# Altium integrated library 74ttl-din.IntLib: 165 symbols
Pins are listed as number, name and electrical type; pins without a type are passive.

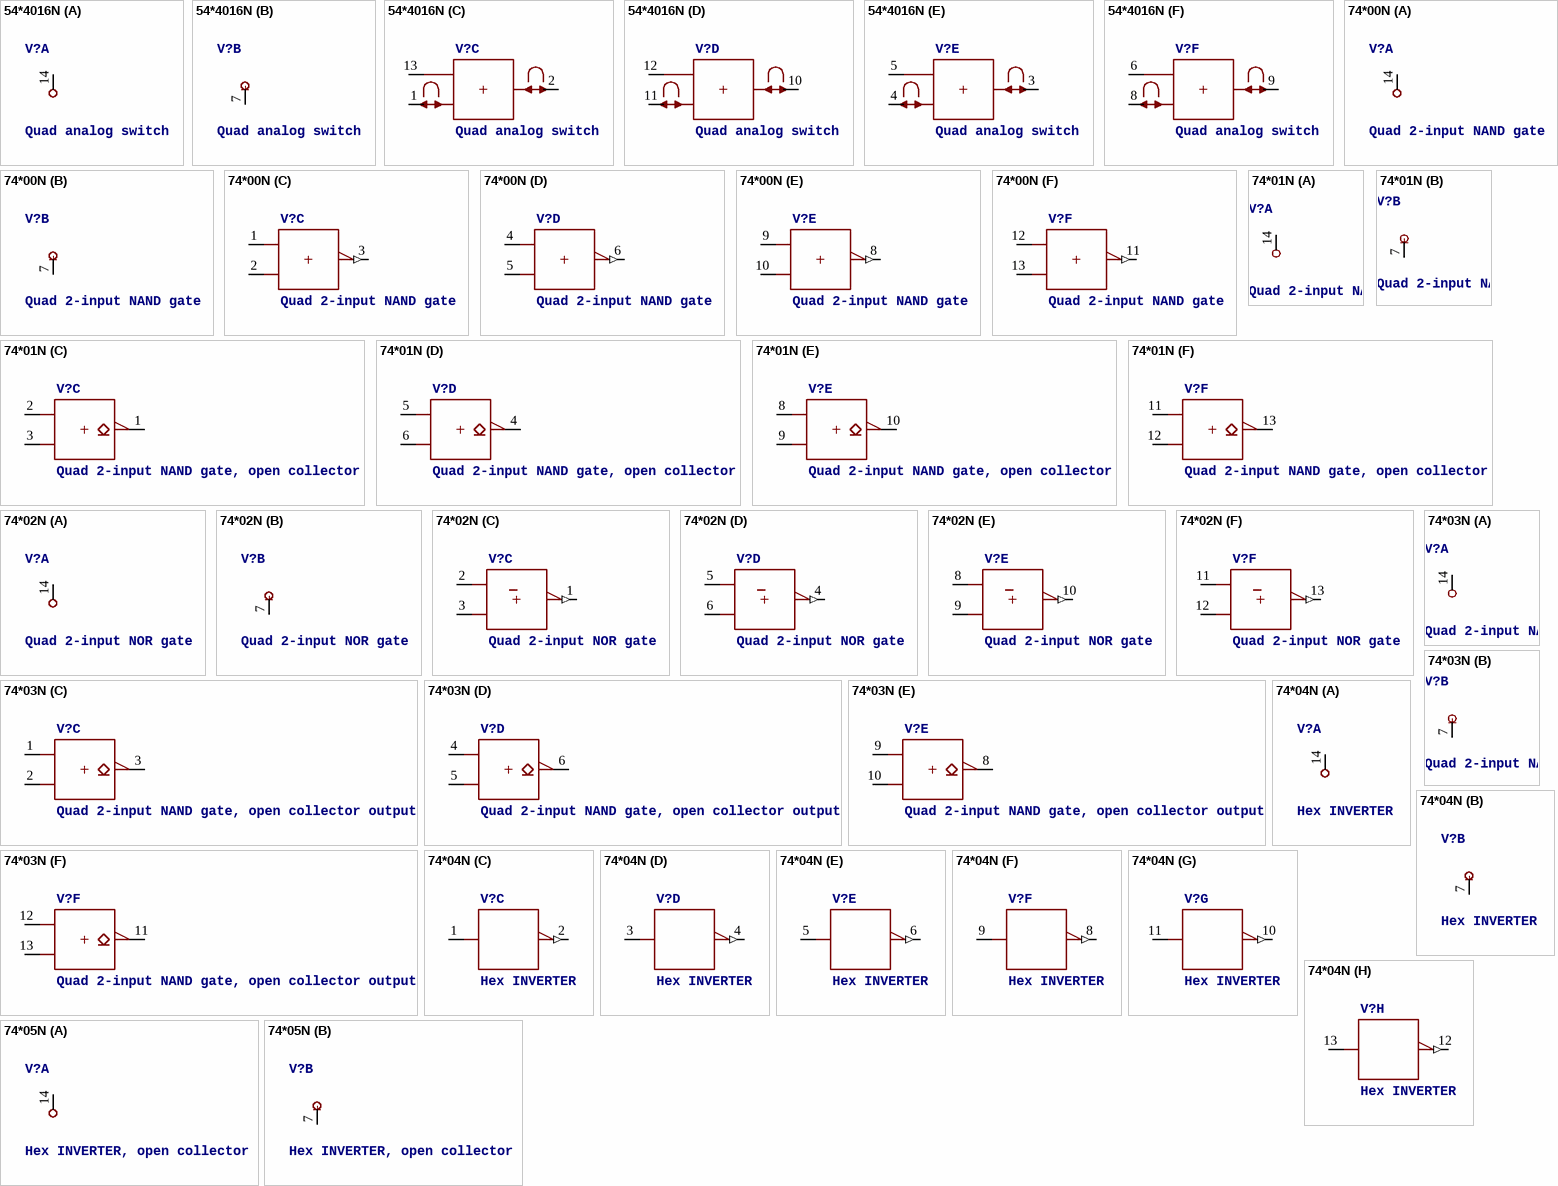
[diagram p0: symbols 54*4016N to 74*05N]

## 54*4016N
designator V?, comment Quad analog switch
footprint DIL14
part A pins: 14 +UB (power)
part B pins: 7 -UB (power)
part C pins: 1 A, 2 B, 13 C
part D pins: 10 B, 11 A, 12 C
part E pins: 3 B, 4 A, 5 C
part F pins: 6 C, 8 A, 9 B

## 74*00N
designator V?, comment Quad 2-input NAND gate
footprint DIL14
part A pins: 14 +UB (power)
part B pins: 7 -UB (power)
part C pins: 1 A, 2 B, 3 Y (out)
part D pins: 4 A, 5 B, 6 Y (out)
part E pins: 8 Y (out), 9 A, 10 B
part F pins: 11 Y (out), 12 A, 13 B

## 74*01N
designator V?, comment Quad 2-input NAND gate, open collector
footprint DIL14
part A pins: 14 +UB (power)
part B pins: 7 -UB (power)
part C pins: 1 Y (oc), 2 A, 3 B
part D pins: 4 Y (oc), 5 A, 6 B
part E pins: 8 A, 9 B, 10 Y (oc)
part F pins: 11 A, 12 B, 13 Y (oc)

## 74*02N
designator V?, comment Quad 2-input NOR gate
footprint DIL14
part A pins: 14 +UB (power)
part B pins: 7 -UB (power)
part C pins: 1 Y (out), 2 A, 3 B
part D pins: 4 Y (out), 5 A, 6 B
part E pins: 8 A, 9 B, 10 Y (out)
part F pins: 11 A, 12 B, 13 Y (out)

## 74*03N
designator V?, comment Quad 2-input NAND gate, open collector output
footprint DIL14
part A pins: 14 +UB (power)
part B pins: 7 -UB (power)
part C pins: 1 A, 2 B, 3 Y (oc)
part D pins: 4 A, 5 B, 6 Y (oc)
part E pins: 8 Y (oc), 9 A, 10 B
part F pins: 11 Y (oc), 12 A, 13 B

## 74*04N
designator V?, comment Hex INVERTER
footprint DIL14
part A pins: 14 +UB (power)
part B pins: 7 -UB (power)
part C pins: 1 A, 2 Y (out)
part D pins: 3 A, 4 Y (out)
part E pins: 5 A, 6 Y (out)
part F pins: 8 Y (out), 9 A
part G pins: 10 Y (out), 11 A
part H pins: 12 Y (out), 13 A

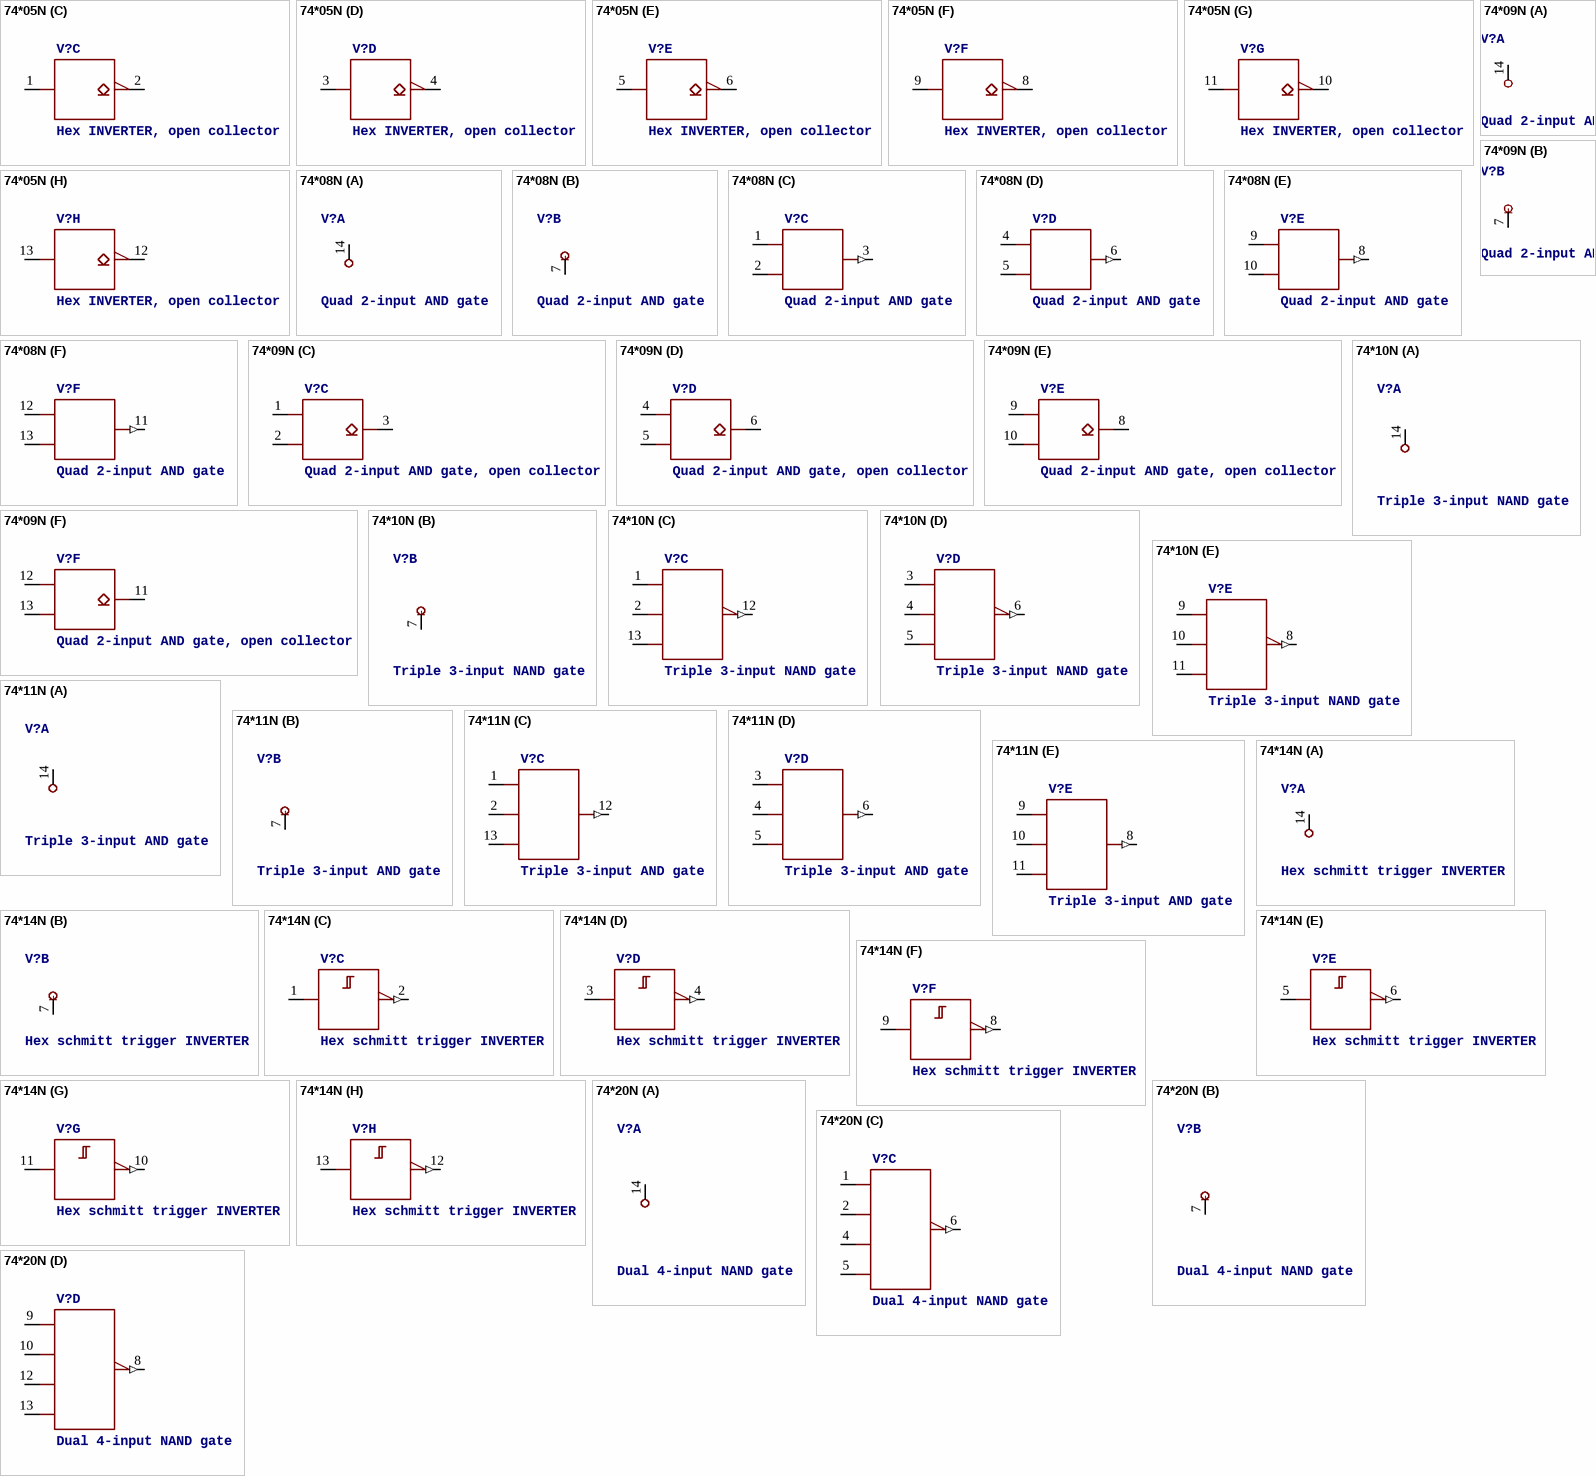
[diagram p1: symbols 74*05N to 74*20N]

## 74*05N
designator V?, comment Hex INVERTER, open collector
footprint DIL14
part A pins: 14 +UB (power)
part B pins: 7 -UB (power)
part C pins: 1 A, 2 Y (oc)
part D pins: 3 A, 4 Y (oc)
part E pins: 5 A, 6 Y (oc)
part F pins: 8 Y (oc), 9 A
part G pins: 10 Y (oc), 11 A
part H pins: 12 Y (oc), 13 A

## 74*08N
designator V?, comment Quad 2-input AND gate
footprint DIL14
part A pins: 14 +UB (power)
part B pins: 7 -UB (power)
part C pins: 1 A, 2 B, 3 Y (out)
part D pins: 4 A, 5 B, 6 Y (out)
part E pins: 8 Y (out), 9 A, 10 B
part F pins: 11 Y (out), 12 A, 13 B

## 74*09N
designator V?, comment Quad 2-input AND gate, open collector
footprint DIL14
part A pins: 14 +UB (power)
part B pins: 7 -UB (power)
part C pins: 1 A, 2 B, 3 Y (oc)
part D pins: 4 A, 5 B, 6 Y (oc)
part E pins: 8 Y (oc), 9 A, 10 B
part F pins: 11 Y (oc), 12 A, 13 B

## 74*10N
designator V?, comment Triple 3-input NAND gate
footprint DIL14
part A pins: 14 +UB (power)
part B pins: 7 -UB (power)
part C pins: 1 A, 2 B, 12 Y (out), 13 C
part D pins: 3 A, 4 B, 5 C, 6 Y (out)
part E pins: 8 Y (out), 9 A, 10 B, 11 C

## 74*11N
designator V?, comment Triple 3-input AND gate
footprint DIL14
part A pins: 14 +UB (power)
part B pins: 7 -UB (power)
part C pins: 1 A, 2 B, 12 Y (out), 13 C
part D pins: 3 A, 4 B, 5 C, 6 Y (out)
part E pins: 8 Y (out), 9 A, 10 B, 11 C

## 74*14N
designator V?, comment Hex schmitt trigger INVERTER
footprint DIL14
part A pins: 14 +UB (power)
part B pins: 7 -UB (power)
part C pins: 1 A, 2 Y (out)
part D pins: 3 A, 4 Y (out)
part E pins: 5 A, 6 Y (out)
part F pins: 8 Y (out), 9 A
part G pins: 10 Y (out), 11 A
part H pins: 12 Y (out), 13 A

## 74*20N
designator V?, comment Dual 4-input NAND gate
footprint DIL14
part A pins: 14 +UB (power)
part B pins: 7 -UB (power)
part C pins: 1 A, 2 B, 4 C, 5 D, 6 Y (out)
part D pins: 8 Y (out), 9 A, 10 B, 12 C, 13 D

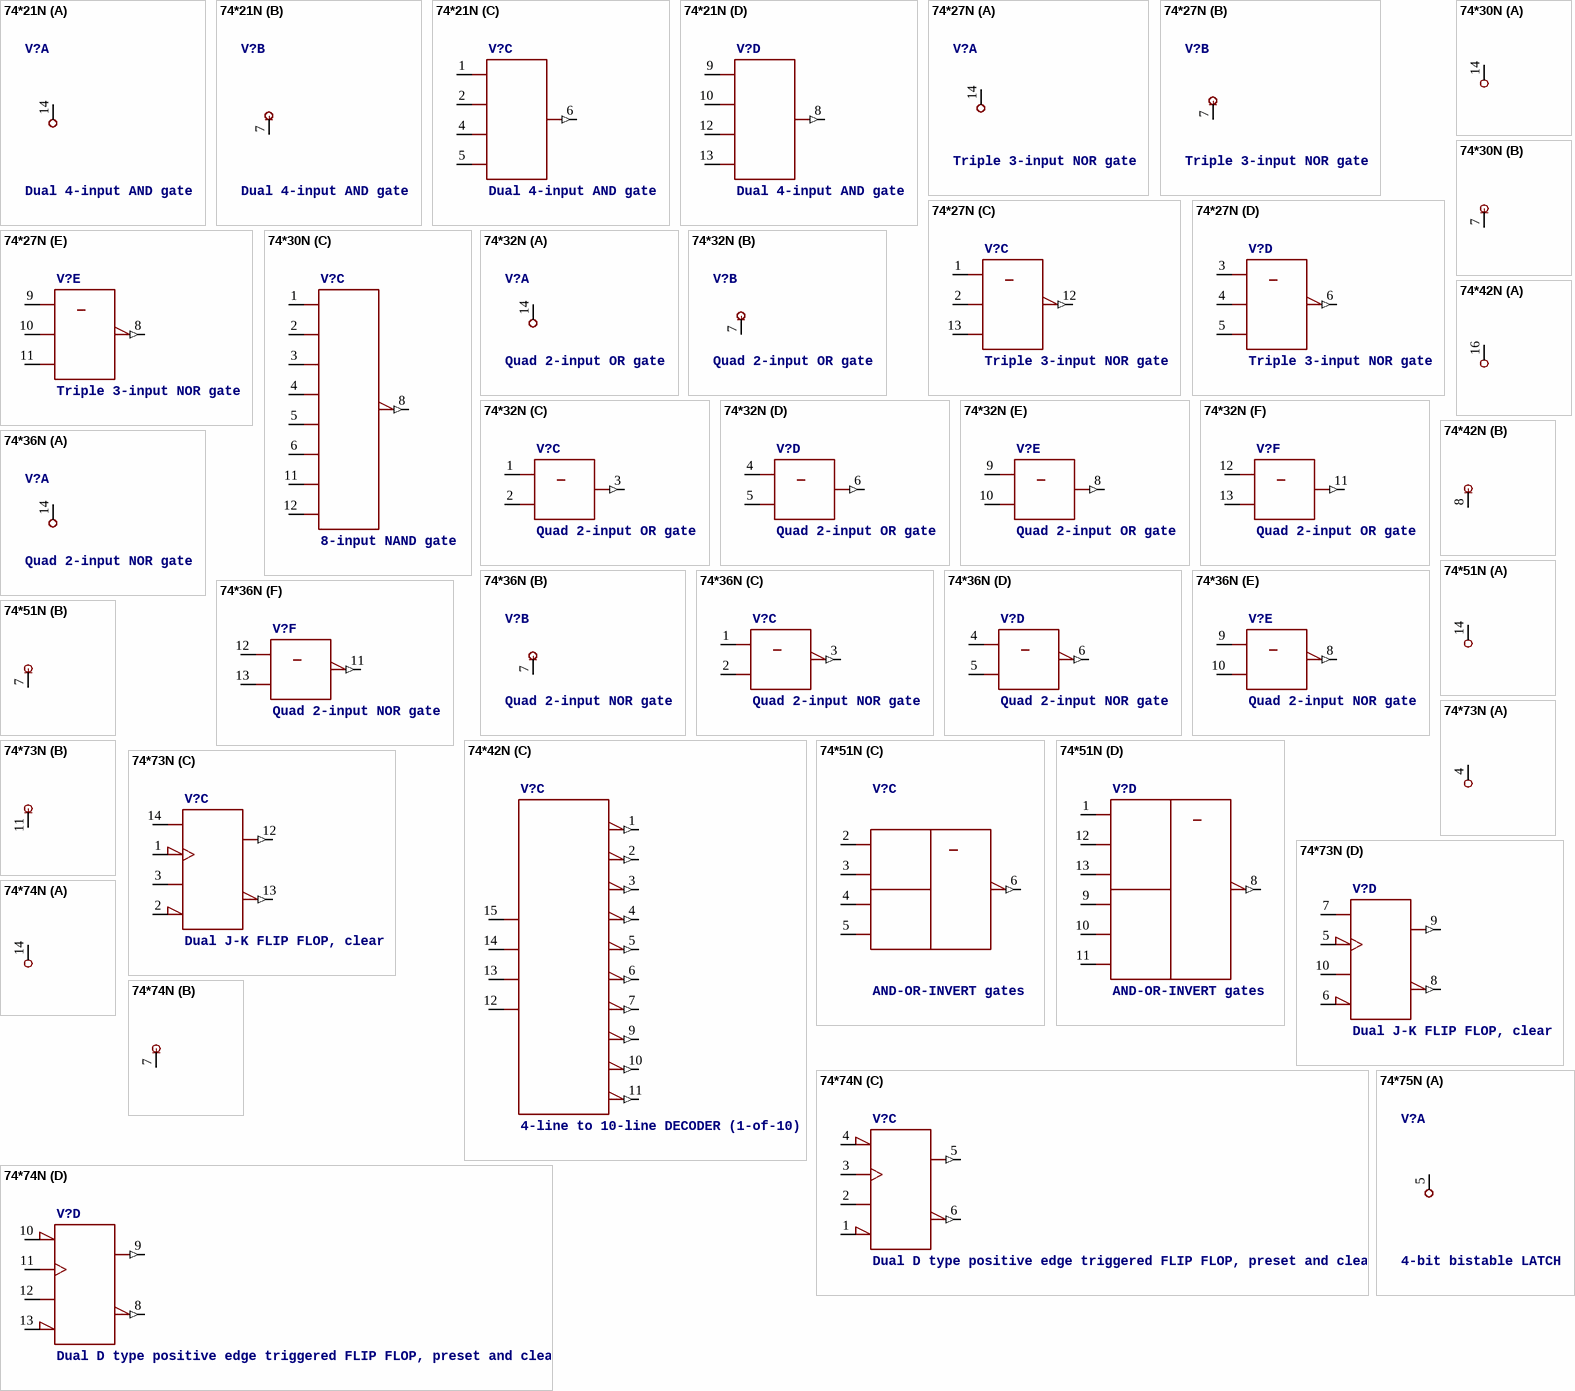
[diagram p2: symbols 74*21N to 74*75N]

## 74*21N
designator V?, comment Dual 4-input AND gate
footprint DIL14
part A pins: 14 +UB (power)
part B pins: 7 -UB (power)
part C pins: 1 A, 2 B, 4 C, 5 D, 6 Y (out)
part D pins: 8 Y (out), 9 A, 10 B, 12 C, 13 D

## 74*27N
designator V?, comment Triple 3-input NOR gate
footprint DIL14
part A pins: 14 +UB (power)
part B pins: 7 -UB (power)
part C pins: 1 A, 2 B, 12 Y (out), 13 C
part D pins: 3 A, 4 B, 5 C, 6 Y (out)
part E pins: 8 Y (out), 9 A, 10 B, 11 C

## 74*30N
designator V?, comment 8-input NAND gate
footprint DIL14
part A pins: 14 +UB (power)
part B pins: 7 -UB (power)
part C pins: 1 A, 2 B, 3 C, 4 D, 5 E, 6 F, 8 Y (out), 11 G, 12 H

## 74*32N
designator V?, comment Quad 2-input OR gate
footprint DIL14
part A pins: 14 +UB (power)
part B pins: 7 -UB (power)
part C pins: 1 A, 2 B, 3 Y (out)
part D pins: 4 A, 5 B, 6 Y (out)
part E pins: 8 Y (out), 9 A, 10 B
part F pins: 11 Y (out), 12 A, 13 B

## 74*36N
designator V?, comment Quad 2-input NOR gate
footprint DIL14
part A pins: 14 +UB (power)
part B pins: 7 -UB (power)
part C pins: 1 A, 2 B, 3 Y (out)
part D pins: 4 A, 5 B, 6 Y (out)
part E pins: 8 Y (out), 9 A, 10 B
part F pins: 11 Y (out), 12 A, 13 B

## 74*42N
designator V?, comment 4-line to 10-line DECODER (1-of-10)
footprint DIL16
part A pins: 16 +UB (power)
part B pins: 8 -UB (power)
part C pins: 1 Y0 (out), 2 Y1 (out), 3 Y2 (out), 4 Y3 (out), 5 Y4 (out), 6 Y5 (out), 7 Y6 (out), 9 Y7 (out), 10 Y8 (out), 11 Y9 (out), 12 D, 13 C, 14 B, 15 A

## 74*51N
designator V?, comment AND-OR-INVERT gates
footprint DIL14
part A pins: 14 +UB (power)
part B pins: 7 -UB (power)
part C pins: 2 A, 3 B, 4 C, 5 D, 6 Y (out)
part D pins: 1 A, 8 Y (out), 9 D, 10 E, 11 F, 12 B, 13 C

## 74*73N
designator V?, comment Dual J-K FLIP FLOP, clear
footprint DIL14
part A pins: 4 +UB (power)
part B pins: 11 -UB (power)
part C pins: 1 CLK, 2 !CLR, 3 K, 12 Q (out), 13 !Q (out), 14 J
part D pins: 5 CLK, 6 !CLR, 7 J, 8 !Q (out), 9 Q (out), 10 K

## 74*74N
designator V?, comment Dual D type positive edge triggered FLIP FLOP, preset and clear
footprint DIL14
part A pins: 14 +UB (power)
part B pins: 7 -UB (power)
part C pins: 1 !CLR, 2 D, 3 CLK, 4 !PRE, 5 Q (out), 6 !Q (out)
part D pins: 8 !Q (out), 9 Q (out), 10 !PRE, 11 CLK, 12 D, 13 !CLR

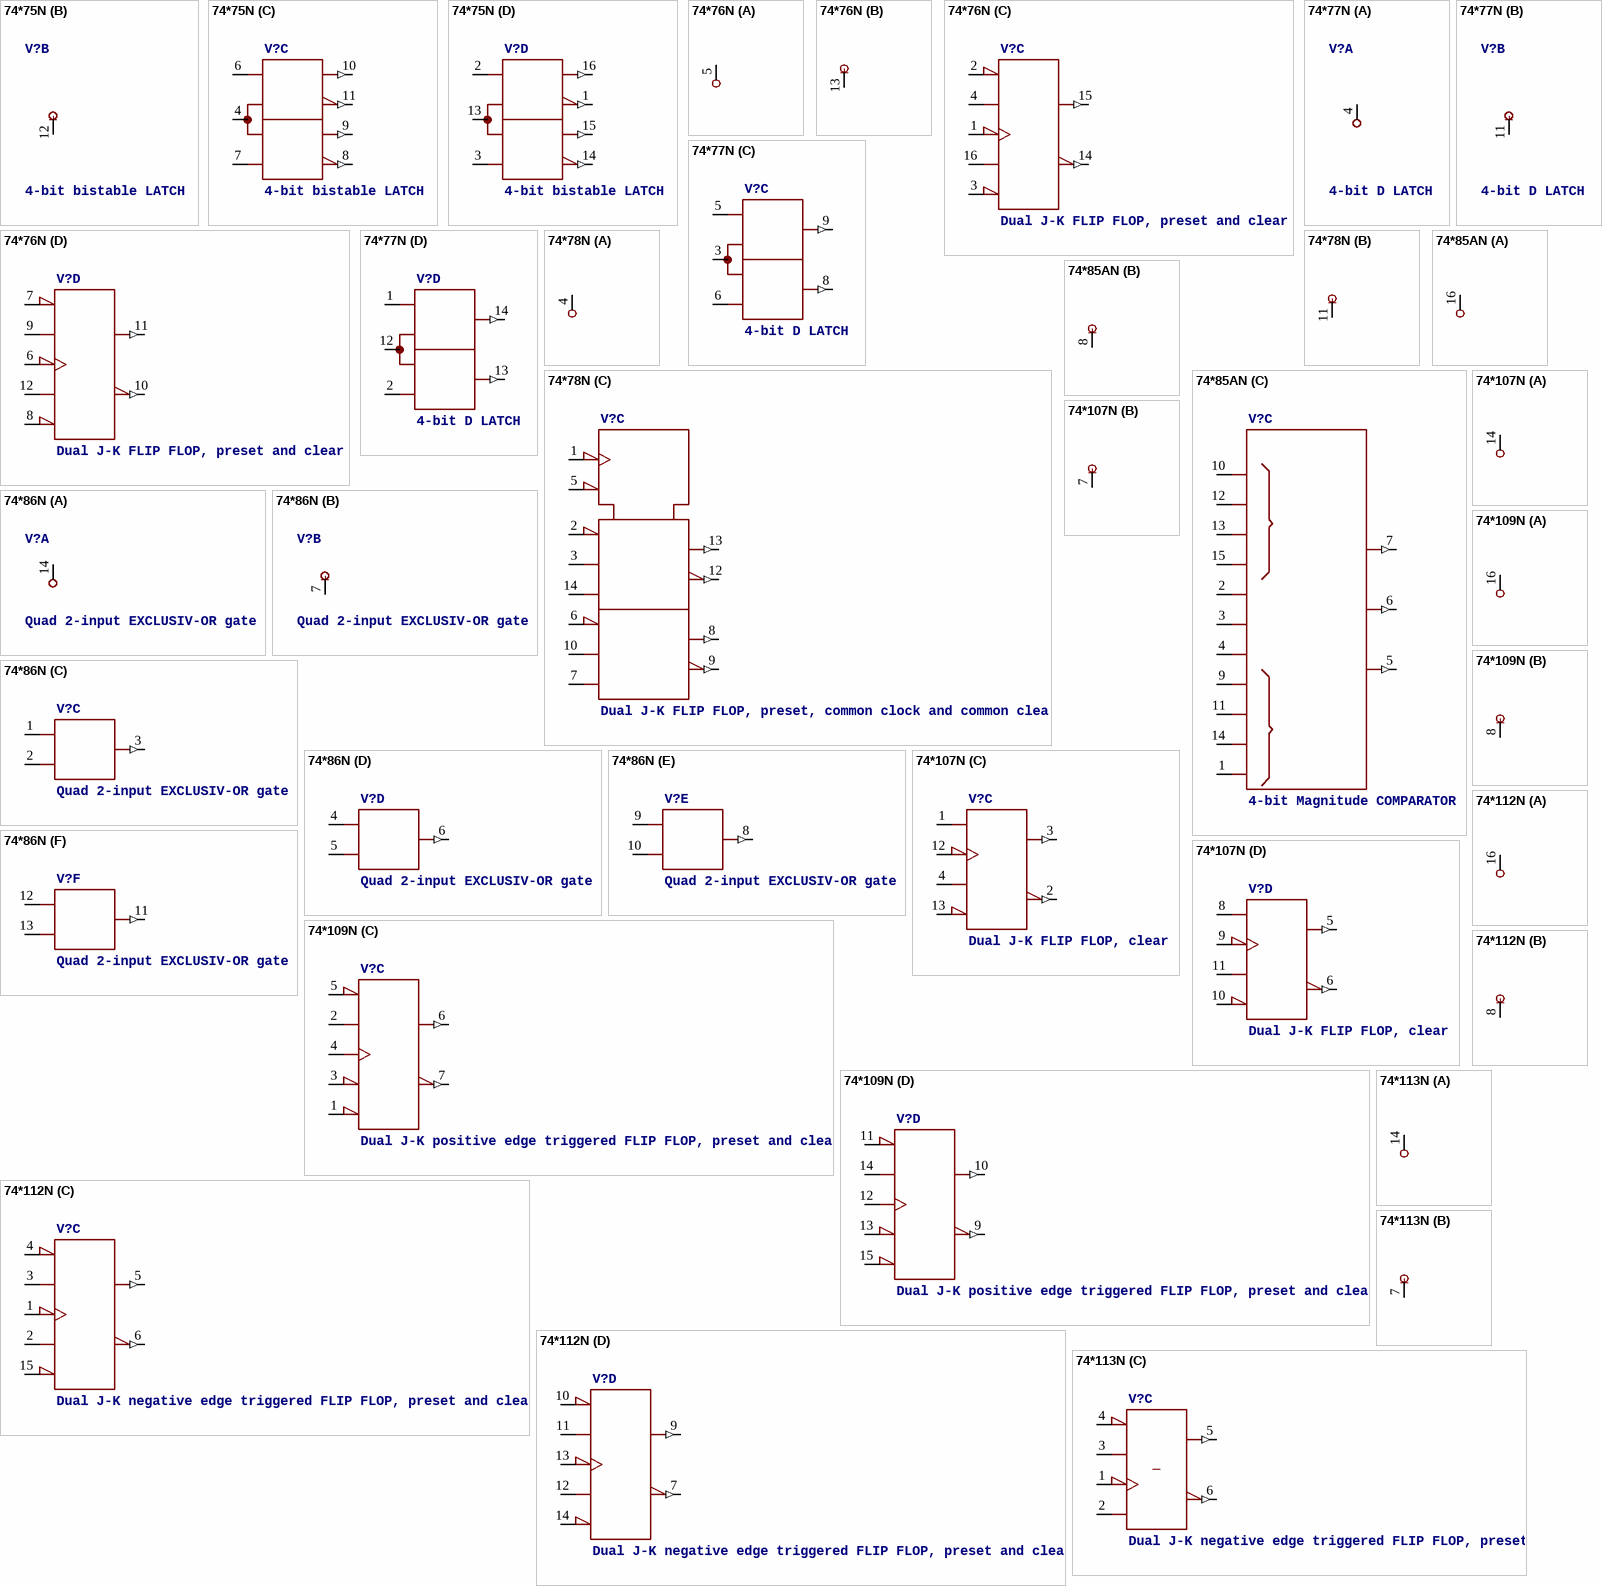
[diagram p3: symbols 74*75N to 74*113N]

## 74*75N
designator V?, comment 4-bit bistable LATCH
footprint DIL16
part A pins: 5 +UB (power)
part B pins: 12 -UB (power)
part C pins: 4 1C,2C, 6 1D, 7 2D, 8 !2Q (out), 9 2Q (out), 10 1Q (out), 11 !1Q (out)
part D pins: 1 !1Q (out), 2 1D, 3 2D, 13 1C,2C, 14 !2Q (out), 15 2Q (out), 16 1Q (out)

## 74*76N
designator V?, comment Dual J-K FLIP FLOP, preset and clear
footprint DIL16
part A pins: 5 +UB (power)
part B pins: 13 -UB (power)
part C pins: 1 CLK, 2 !PRE, 3 !CLR, 4 J, 14 !Q (out), 15 Q (out), 16 K
part D pins: 6 CLK, 7 !PRE, 8 !CLR, 9 J, 10 !Q (out), 11 Q (out), 12 K

## 74*77N
designator V?, comment 4-bit D LATCH
footprint DIL14
part A pins: 4 +UB (power)
part B pins: 11 -UB (power)
part C pins: 3 1C,2C, 5 1D, 6 2D, 8 2Q (out), 9 1Q (out)
part D pins: 1 1D, 2 2D, 12 1C,2C, 13 2Q (out), 14 1Q (out)

## 74*78N
designator V?, comment Dual J-K FLIP FLOP, preset, common clock and common clear
footprint DIL14
part A pins: 4 +UB (power)
part B pins: 11 -UB (power)
part C pins: 1 CLK, 2 !1PRE, 3 1J, 5 !CLR, 6 !2PRE, 7 2K, 8 2Q (out), 9 !2Q (out), 10 2J, 12 !1Q (out), 13 1Q (out), 14 1K

## 74*85AN
designator V?, comment 4-bit Magnitude COMPARATOR
footprint DIL16
part A pins: 16 +UB (power)
part B pins: 8 -UB (power)
part C pins: 1 Q3, 2 PLTQ_, 3 PEQQ_, 4 PGTQ_, 5 PGTQ (out), 6 PEQQ (out), 7 PLTQ (out), 9 Q0, 10 P0, 11 Q1, 12 P1, 13 P2, 14 Q2, 15 P3

## 74*86N
designator V?, comment Quad 2-input EXCLUSIV-OR gate
footprint DIL14
part A pins: 14 +UB (power)
part B pins: 7 -UB (power)
part C pins: 1 A, 2 B, 3 Y (out)
part D pins: 4 A, 5 B, 6 Y (out)
part E pins: 8 Y (out), 9 A, 10 B
part F pins: 11 Y (out), 12 A, 13 B

## 74*107N
designator V?, comment Dual J-K FLIP FLOP, clear
footprint DIL14
part A pins: 14 +UB (power)
part B pins: 7 -UB (power)
part C pins: 1 J, 2 !Q (out), 3 Q (out), 4 K, 12 CLK, 13 !CLR
part D pins: 5 Q (out), 6 !Q (out), 8 J, 9 CLK, 10 !CLR, 11 K

## 74*109N
designator V?, comment Dual J-K positive edge triggered FLIP FLOP, preset and clear
footprint DIL16
part A pins: 16 +UB (power)
part B pins: 8 -UB (power)
part C pins: 1 !CLR, 2 J, 3 !K, 4 CLK, 5 !PRE, 6 Q (out), 7 !Q (out)
part D pins: 9 !Q (out), 10 Q (out), 11 !PRE, 12 CLK, 13 !K, 14 J, 15 !CLR

## 74*112N
designator V?, comment Dual J-K negative edge triggered FLIP FLOP, preset and clear
footprint DIL16
part A pins: 16 +UB (power)
part B pins: 8 -UB (power)
part C pins: 1 CLK, 2 K, 3 J, 4 !PRE, 5 Q (out), 6 !Q (out), 15 !CLR
part D pins: 7 !Q (out), 9 Q (out), 10 !PRE, 11 J, 12 K, 13 CLK, 14 !CLR

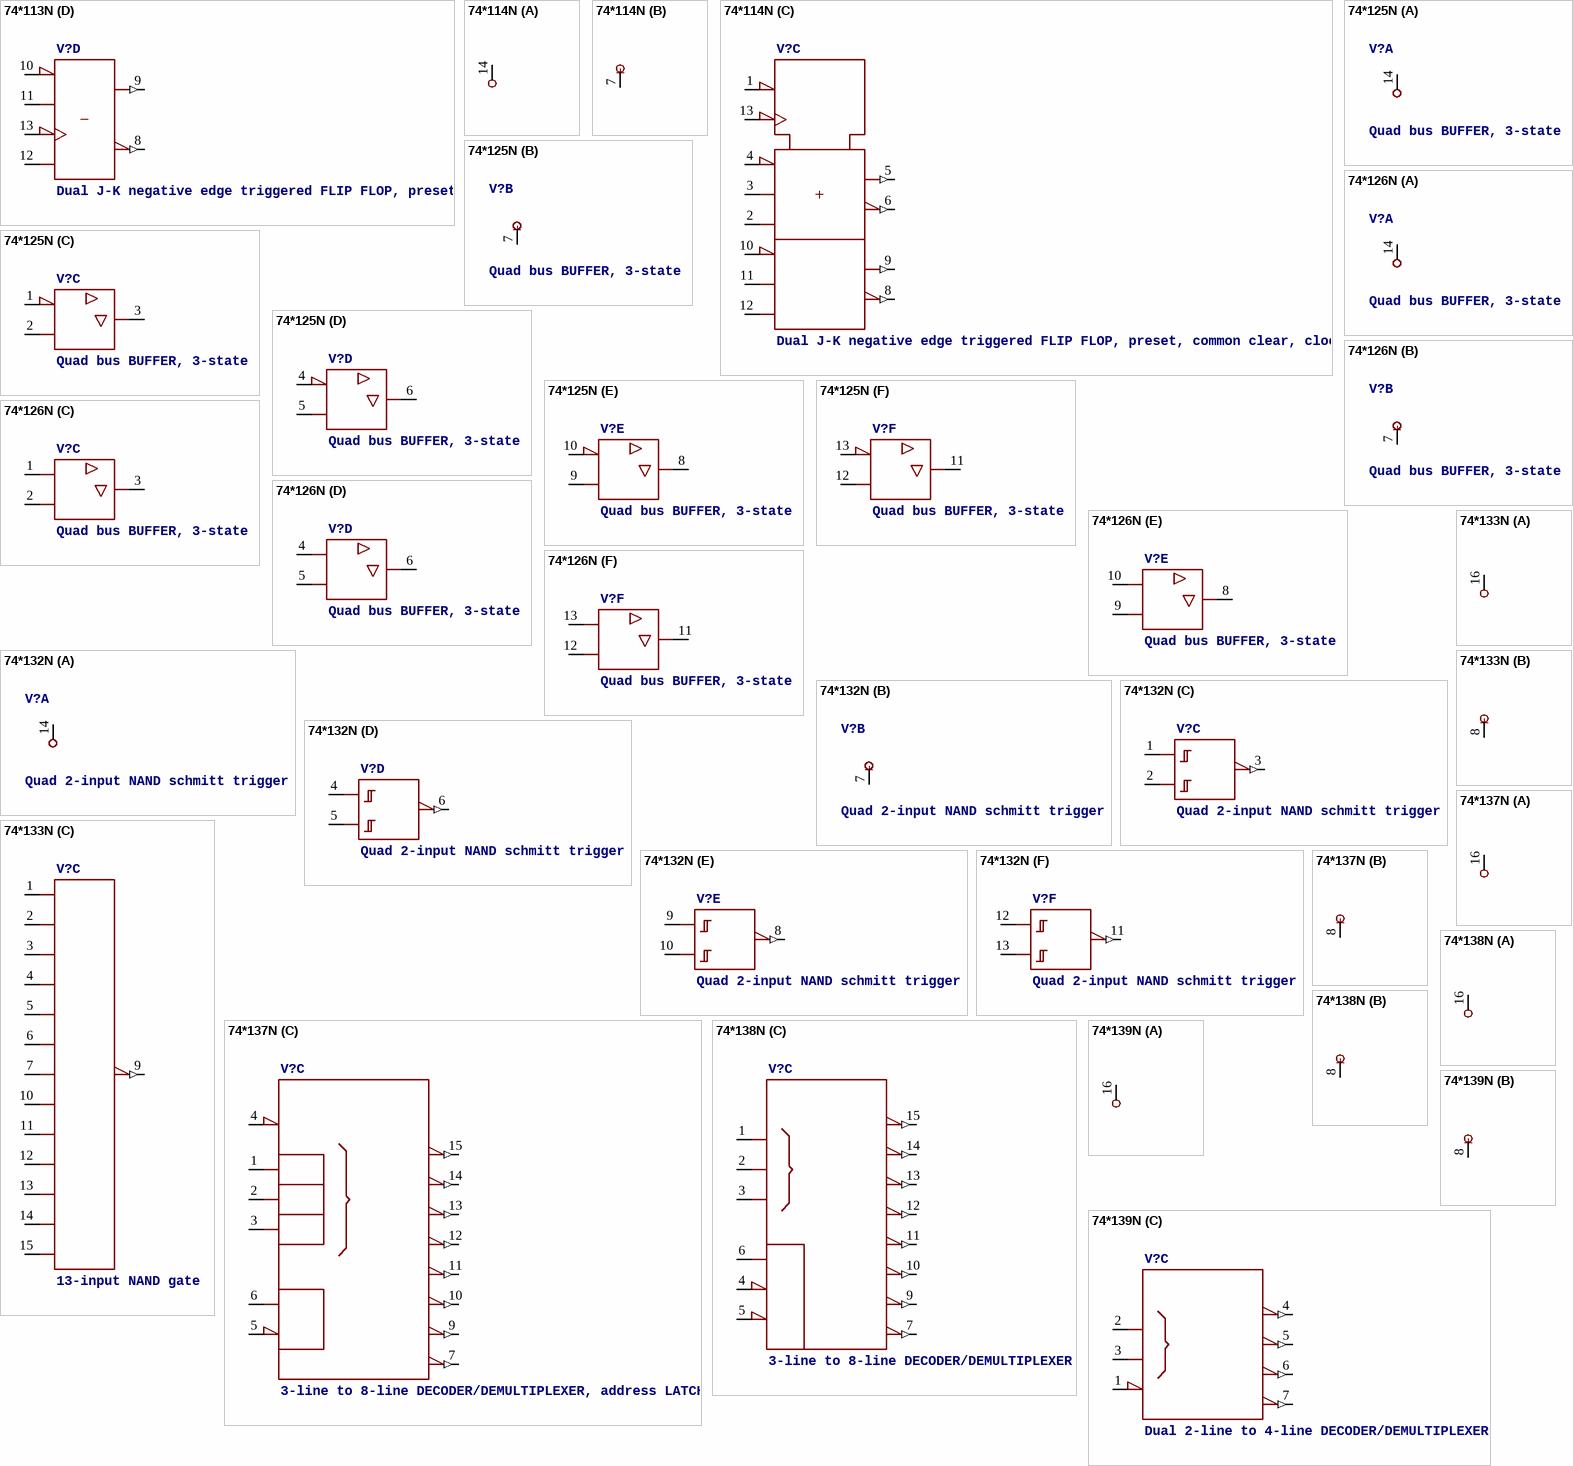
[diagram p4: symbols 74*113N to 74*139N]

## 74*113N
designator V?, comment Dual J-K negative edge triggered FLIP FLOP, preset
footprint DIL14
part A pins: 14 +UB (power)
part B pins: 7 -UB (power)
part C pins: 1 CLK, 2 K, 3 J, 4 !PRE, 5 Q (out), 6 !Q (out)
part D pins: 8 !Q (out), 9 Q (out), 10 !PRE, 11 J, 12 K, 13 CLK

## 74*114N
designator V?, comment Dual J-K negative edge triggered FLIP FLOP, preset, common clear, clock
footprint DIL14
part A pins: 14 +UB (power)
part B pins: 7 -UB (power)
part C pins: 1 !CLR, 2 1K, 3 1J, 4 !1PRE, 5 1Q (out), 6 !1Q (out), 8 !2Q (out), 9 2Q (out), 10 !2PRE, 11 2J, 12 2K, 13 CLK

## 74*125N
designator V?, comment Quad bus BUFFER, 3-state
footprint DIL14
part A pins: 14 +UB (power)
part B pins: 7 -UB (power)
part C pins: 1 !G, 2 A, 3 Y (hiz)
part D pins: 4 !G, 5 A, 6 Y (hiz)
part E pins: 8 Y (hiz), 9 A, 10 !G
part F pins: 11 Y (hiz), 12 A, 13 !G

## 74*126N
designator V?, comment Quad bus BUFFER, 3-state
footprint DIL14
part A pins: 14 +UB (power)
part B pins: 7 -UB (power)
part C pins: 1 G, 2 A, 3 Y (hiz)
part D pins: 4 G, 5 A, 6 Y (hiz)
part E pins: 8 Y (hiz), 9 A, 10 G
part F pins: 11 Y (hiz), 12 A, 13 G

## 74*132N
designator V?, comment Quad 2-input NAND schmitt trigger
footprint DIL14
part A pins: 14 +UB (power)
part B pins: 7 -UB (power)
part C pins: 1 A, 2 B, 3 Y (out)
part D pins: 4 A, 5 B, 6 Y (out)
part E pins: 8 Y (out), 9 A, 10 B
part F pins: 11 Y (out), 12 A, 13 B

## 74*133N
designator V?, comment 13-input NAND gate
footprint DIL16
part A pins: 16 +UB (power)
part B pins: 8 -UB (power)
part C pins: 1 A, 2 B, 3 C, 4 D, 5 E, 6 F, 7 G, 9 Y (out), 10 H, 11 I, 12 J, 13 K, 14 L, 15 M

## 74*137N
designator V?, comment 3-line to 8-line DECODER/DEMULTIPLEXER, address LATCH
footprint DIL16
part A pins: 16 +UB (power)
part B pins: 8 -UB (power)
part C pins: 1 A, 2 B, 3 C, 4 !GL, 5 !G2, 6 G1, 7 Y7 (out), 9 Y6 (out), 10 Y5 (out), 11 Y4 (out), 12 Y3 (out), 13 Y2 (out), 14 Y1 (out), 15 Y0 (out)

## 74*138N
designator V?, comment 3-line to 8-line DECODER/DEMULTIPLEXER
footprint DIL16
part A pins: 16 +UB (power)
part B pins: 8 -UB (power)
part C pins: 1 A, 2 B, 3 C, 4 !G2A, 5 !G2B, 6 G1, 7 Y7 (out), 9 Y6 (out), 10 Y5 (out), 11 Y4 (out), 12 Y3 (out), 13 Y2 (out), 14 Y1 (out), 15 Y0 (out)

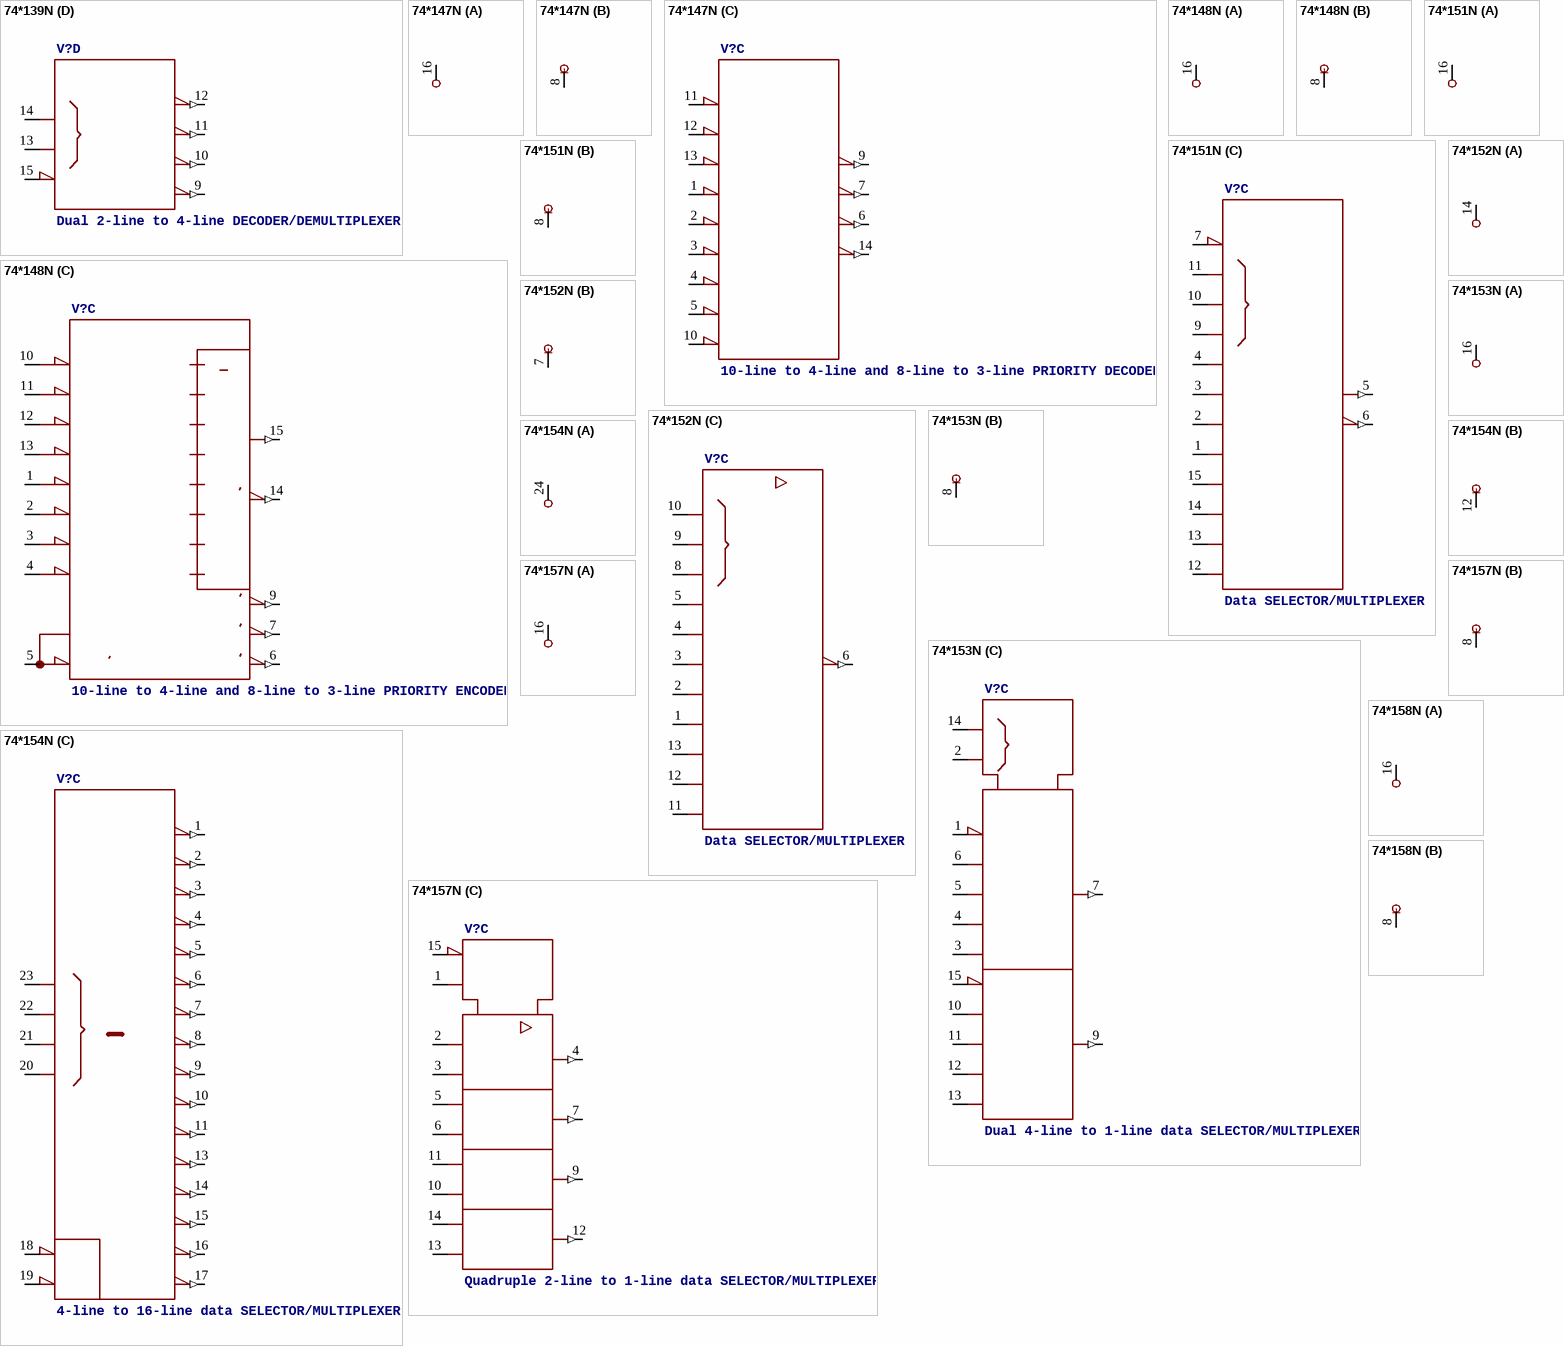
[diagram p5: symbols 74*139N to 74*158N]

## 74*139N
designator V?, comment Dual 2-line to 4-line DECODER/DEMULTIPLEXER
footprint DIL16
part A pins: 16 +UB (power)
part B pins: 8 -UB (power)
part C pins: 1 !G, 2 A, 3 B, 4 Y0 (out), 5 Y1 (out), 6 Y2 (out), 7 Y3 (out)
part D pins: 9 Y3 (out), 10 Y2 (out), 11 Y1 (out), 12 Y0 (out), 13 B, 14 A, 15 !G

## 74*147N
designator V?, comment 10-line to 4-line and 8-line to 3-line PRIORITY DECODER
footprint DIL16
part A pins: 16 +UB (power)
part B pins: 8 -UB (power)
part C pins: 1 4, 2 5, 3 6, 4 7, 5 8, 6 C (out), 7 B (out), 9 A (out), 10 9, 11 1, 12 2, 13 3, 14 D (out)

## 74*148N
designator V?, comment 10-line to 4-line and 8-line to 3-line PRIORITY ENCODER
footprint DIL16
part A pins: 16 +UB (power)
part B pins: 8 -UB (power)
part C pins: 1 4, 2 5, 3 6, 4 7, 5 EI, 6 A2 (out), 7 A1 (out), 9 A0 (out), 10 0, 11 1, 12 2, 13 3, 14 GS (out), 15 EO (out)

## 74*151N
designator V?, comment Data SELECTOR/MULTIPLEXER
footprint DIL16
part A pins: 16 +UB (power)
part B pins: 8 -UB (power)
part C pins: 1 D3, 2 D2, 3 D1, 4 D0, 5 Y (out), 6 W (out), 7 !G, 9 C, 10 B, 11 A, 12 D7, 13 D6, 14 D5, 15 D4

## 74*152N
designator V?, comment Data SELECTOR/MULTIPLEXER
footprint DIL14
part A pins: 14 +UB (power)
part B pins: 7 -UB (power)
part C pins: 1 D4, 2 D3, 3 D2, 4 D1, 5 D0, 6 W (out), 8 C, 9 B, 10 A, 11 D7, 12 D6, 13 D5

## 74*153N
designator V?, comment Dual 4-line to 1-line data SELECTOR/MULTIPLEXER
footprint DIL16
part A pins: 16 +UB (power)
part B pins: 8 -UB (power)
part C pins: 1 !1G, 2 B, 3 1C3, 4 1C2, 5 1C1, 6 1C0, 7 1Y (out), 9 2Y (out), 10 2C0, 11 2C1, 12 2C2, 13 2C3, 14 A, 15 !2G

## 74*154N
designator V?, comment 4-line to 16-line data SELECTOR/MULTIPLEXER
footprint DIL24-3
part A pins: 24 +UB (power)
part B pins: 12 -UB (power)
part C pins: 1 0 (out), 2 1 (out), 3 2 (out), 4 3 (out), 5 4 (out), 6 5 (out), 7 6 (out), 8 7 (out), 9 8 (out), 10 9 (out), 11 10 (out), 13 11 (out), 14 12 (out), 15 13 (out), 16 14 (out), 17 15 (out), 18 !G1, 19 !G2, 20 D, 21 C, 22 B, 23 A

## 74*157N
designator V?, comment Quadruple 2-line to 1-line data SELECTOR/MULTIPLEXER
footprint DIL16
part A pins: 16 +UB (power)
part B pins: 8 -UB (power)
part C pins: 1 !A!/B, 2 1A, 3 1B, 4 1Y (out), 5 2A, 6 2B, 7 2Y (out), 9 3Y (out), 10 3B, 11 3A, 12 4Y (out), 13 4B, 14 4A, 15 !G

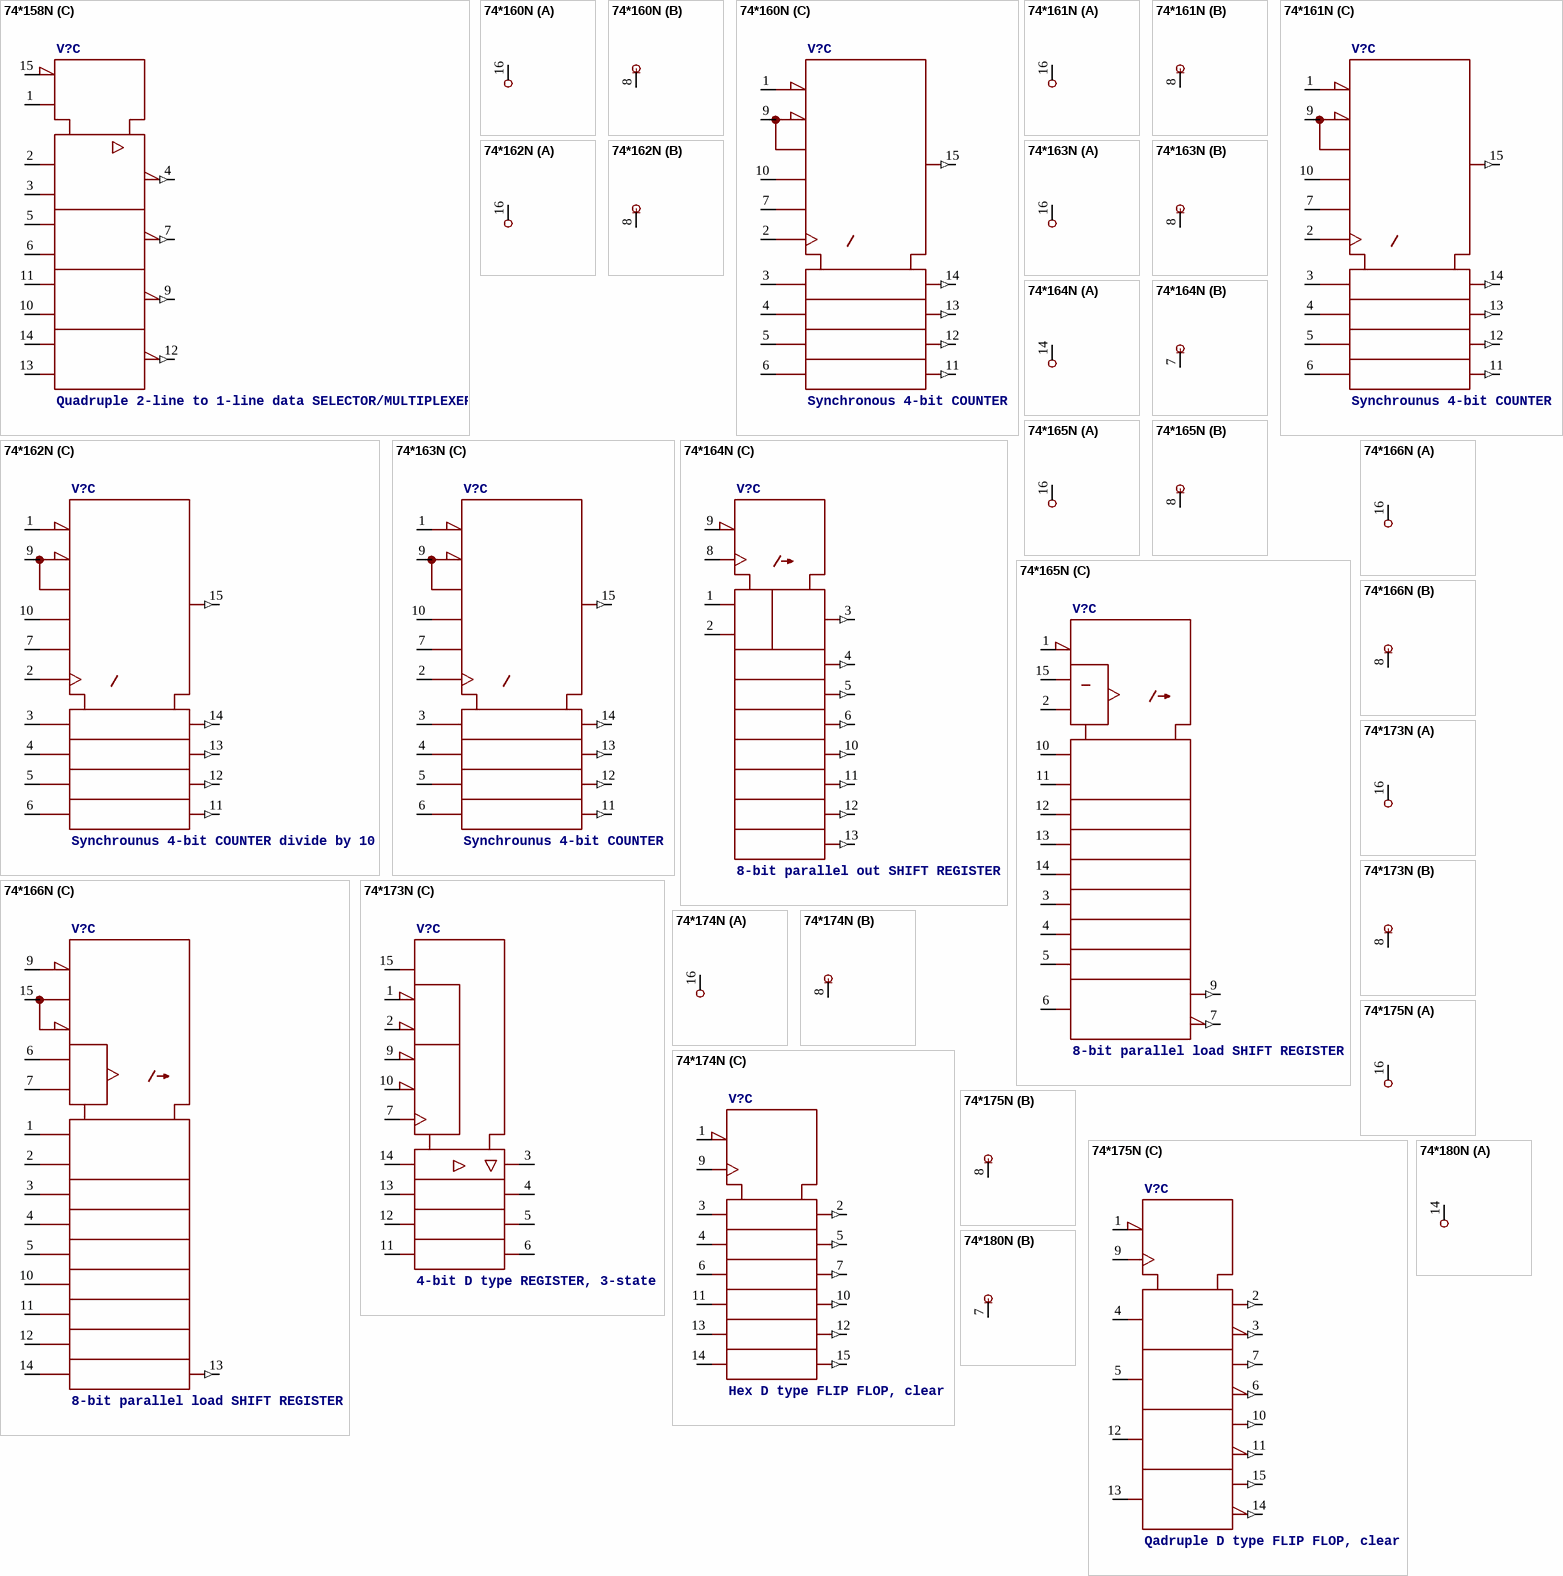
[diagram p6: symbols 74*158N to 74*180N]

## 74*158N
designator V?, comment Quadruple 2-line to 1-line data SELECTOR/MULTIPLEXER
footprint DIL16
part A pins: 16 +UB (power)
part B pins: 8 -UB (power)
part C pins: 1 !A!/B, 2 1A, 3 1B, 4 1Y (out), 5 2A, 6 2B, 7 2Y (out), 9 3Y (out), 10 3B, 11 3A, 12 4Y (out), 13 4B, 14 4A, 15 !G

## 74*160N
designator V?, comment Synchronous 4-bit COUNTER
footprint DIL16
part A pins: 16 +UB (power)
part B pins: 8 -UB (power)
part C pins: 1 !CLR, 2 CLK, 3 A, 4 B, 5 C, 6 D, 7 ENP, 9 !LOAD, 10 ENT, 11 QD (out), 12 QC (out), 13 QB (out), 14 QA (out), 15 RCO (out)

## 74*161N
designator V?, comment Synchrounus 4-bit COUNTER
footprint DIL16
part A pins: 16 +UB (power)
part B pins: 8 -UB (power)
part C pins: 1 !CLR, 2 CLK, 3 A, 4 B, 5 C, 6 D, 7 ENP, 9 !LOAD, 10 ENT, 11 QD (out), 12 QC (out), 13 QB (out), 14 QA (out), 15 RCO (out)

## 74*162N
designator V?, comment Synchrounus 4-bit COUNTER divide by 10
footprint DIL16
part A pins: 16 +UB (power)
part B pins: 8 -UB (power)
part C pins: 1 !CLR, 2 CLK, 3 A, 4 B, 5 C, 6 D, 7 ENP, 9 !LOAD, 10 ENT, 11 QD (out), 12 QC (out), 13 QB (out), 14 QA (out), 15 RCO (out)

## 74*163N
designator V?, comment Synchrounus 4-bit COUNTER
footprint DIL16
part A pins: 16 +UB (power)
part B pins: 8 -UB (power)
part C pins: 1 !CLR, 2 CLK, 3 A, 4 B, 5 C, 6 D, 7 ENP, 9 !LOAD, 10 ENT, 11 QD (out), 12 QC (out), 13 QB (out), 14 QA (out), 15 RCO (out)

## 74*164N
designator V?, comment 8-bit parallel out SHIFT REGISTER
footprint DIL14
part A pins: 14 +UB (power)
part B pins: 7 -UB (power)
part C pins: 1 A, 2 B, 3 QA (out), 4 QB (out), 5 QC (out), 6 QD (out), 8 CLK, 9 !CLR, 10 QE (out), 11 QF (out), 12 QG (out), 13 QH (out)

## 74*165N
designator V?, comment 8-bit parallel load SHIFT REGISTER
footprint DIL16
part A pins: 16 +UB (power)
part B pins: 8 -UB (power)
part C pins: 1 SH/!LD, 2 CLK, 3 E, 4 F, 5 G, 6 H, 7 !QH (out), 9 QH (out), 10 SER, 11 A, 12 B, 13 C, 14 D, 15 CLK_INH

## 74*166N
designator V?, comment 8-bit parallel load SHIFT REGISTER
footprint DIL16
part A pins: 16 +UB (power)
part B pins: 8 -UB (power)
part C pins: 1 SER, 2 A, 3 B, 4 C, 5 D, 6 CLK_INH, 7 CLK, 9 !CLR, 10 E, 11 F, 12 G, 13 QH (out), 14 H, 15 SH/!LD

## 74*173N
designator V?, comment 4-bit D type REGISTER, 3-state
footprint DIL16
part A pins: 16 +UB (power)
part B pins: 8 -UB (power)
part C pins: 1 M, 2 N, 3 1Q (hiz), 4 2Q (hiz), 5 3Q (hiz), 6 4Q (hiz), 7 CLK, 9 !G1, 10 !G2, 11 4D, 12 3D, 13 2D, 14 1D, 15 CLR

## 74*174N
designator V?, comment Hex D type FLIP FLOP, clear
footprint DIL16
part A pins: 16 +UB (power)
part B pins: 8 -UB (power)
part C pins: 1 !CLR, 2 1Q (out), 3 1D, 4 2D, 5 2Q (out), 6 3D, 7 3Q (out), 9 CLK, 10 4Q (out), 11 4D, 12 5Q (out), 13 5D, 14 6D, 15 6Q (out)

## 74*175N
designator V?, comment Qadruple D type FLIP FLOP, clear
footprint DIL16
part A pins: 16 +UB (power)
part B pins: 8 -UB (power)
part C pins: 1 !CLR, 2 1Q (out), 3 !1Q (out), 4 1D, 5 2D, 6 !2Q (out), 7 2Q (out), 9 CLK, 10 3Q (out), 11 !3Q (out), 12 3D, 13 4D, 14 !4Q (out), 15 4Q (out)

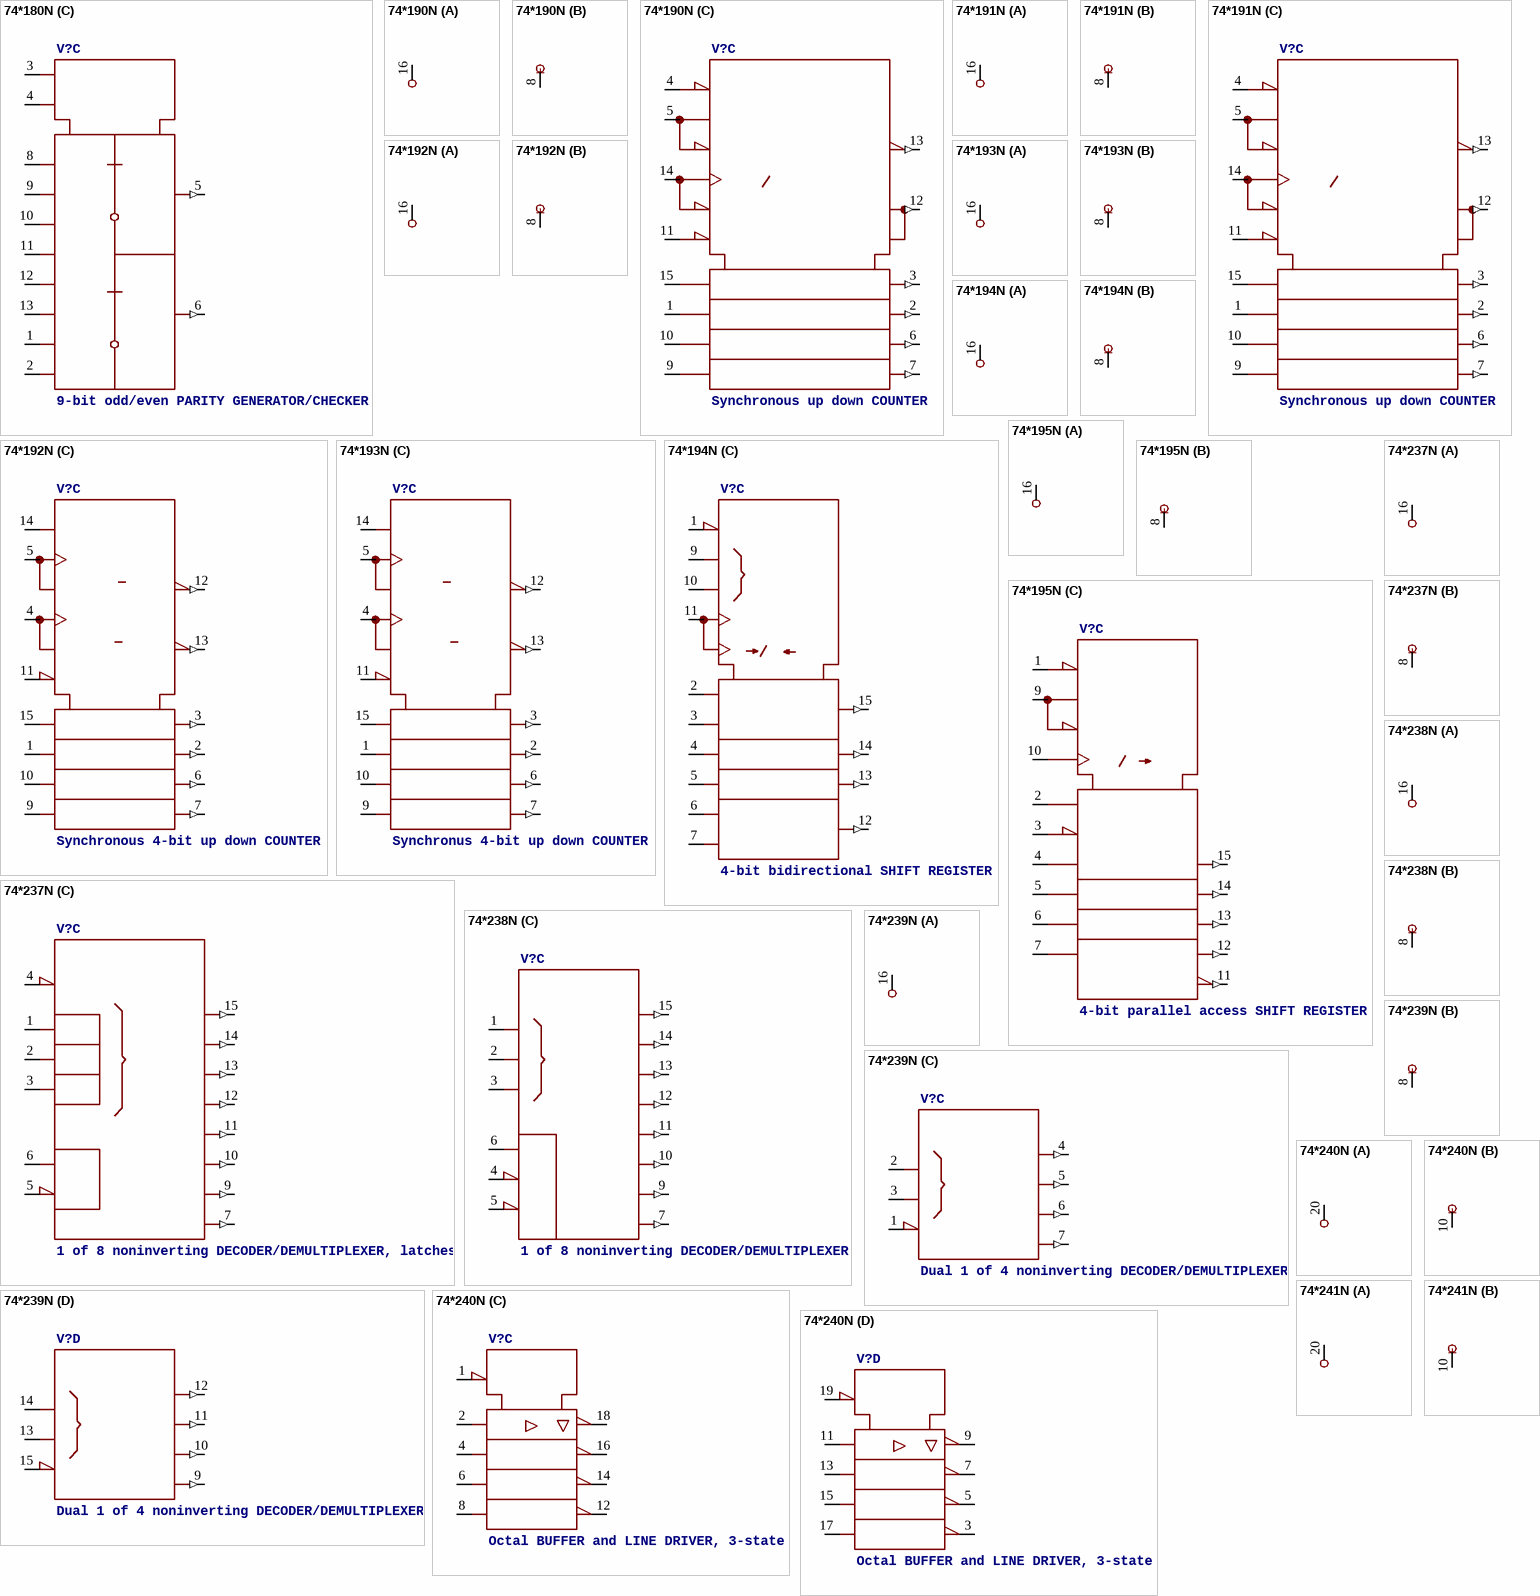
[diagram p7: symbols 74*180N to 74*241N]

## 74*180N
designator V?, comment 9-bit odd/even PARITY GENERATOR/CHECKER
footprint DIL14
part A pins: 14 +UB (power)
part B pins: 7 -UB (power)
part C pins: 1 G, 2 H, 3 EVEN, 4 ODD, 5 SEVEN (out), 6 SODD (out), 8 A, 9 B, 10 C, 11 D, 12 E, 13 F

## 74*190N
designator V?, comment Synchronous up down COUNTER
footprint DIL16
part A pins: 16 +UB (power)
part B pins: 8 -UB (power)
part C pins: 1 B, 2 QB (out), 3 QA (out), 4 !CTEN, 5 D/!U, 6 QC (out), 7 QD (out), 9 D, 10 C, 11 !LOAD, 12 MAX/MIN (out), 13 !RCO (out), 14 CLK, 15 A

## 74*191N
designator V?, comment Synchronous up down COUNTER
footprint DIL16
part A pins: 16 +UB (power)
part B pins: 8 -UB (power)
part C pins: 1 B, 2 QB (out), 3 QA (out), 4 !CTEN, 5 D/!U, 6 QC (out), 7 QD (out), 9 D, 10 C, 11 !LOAD, 12 MAX/MIN (out), 13 !RCO (out), 14 CLK, 15 A

## 74*192N
designator V?, comment Synchronous 4-bit up down COUNTER
footprint DIL16
part A pins: 16 +UB (power)
part B pins: 8 -UB (power)
part C pins: 1 B, 2 QB (out), 3 QA (out), 4 DOWN, 5 UP, 6 QC (out), 7 QD (out), 9 D, 10 C, 11 !LOAD, 12 !CO (out), 13 !BO (out), 14 CLR, 15 A

## 74*193N
designator V?, comment Synchronus 4-bit up down COUNTER
footprint DIL16
part A pins: 16 +UB (power)
part B pins: 8 -UB (power)
part C pins: 1 B, 2 QB (out), 3 QA (out), 4 DOWN, 5 UP, 6 QC (out), 7 QD (out), 9 D, 10 C, 11 !LOAD, 12 !CO (out), 13 !BO (out), 14 CLR, 15 A

## 74*194N
designator V?, comment 4-bit bidirectional SHIFT REGISTER
footprint DIL16
part A pins: 16 +UB (power)
part B pins: 8 -UB (power)
part C pins: 1 !CLR, 2 SR_SER, 3 A, 4 B, 5 C, 6 D, 7 SL_SER, 9 S0, 10 S1, 11 CLK, 12 QD (out), 13 QC (out), 14 QB (out), 15 QA (out)

## 74*195N
designator V?, comment 4-bit parallel access SHIFT REGISTER
footprint DIL16
part A pins: 16 +UB (power)
part B pins: 8 -UB (power)
part C pins: 1 !CLR, 2 J, 3 !K, 4 A, 5 B, 6 C, 7 D, 9 SH/!LD, 10 CLK, 11 !QD (out), 12 QD (out), 13 QC (out), 14 QB (out), 15 QA (out)

## 74*237N
designator V?, comment 1 of 8 noninverting DECODER/DEMULTIPLEXER, latches
footprint DIL16
part A pins: 16 +UB (power)
part B pins: 8 -UB (power)
part C pins: 1 A, 2 B, 3 C, 4 !GL, 5 !G2, 6 G1, 7 Y7 (out), 9 Y6 (out), 10 Y5 (out), 11 Y4 (out), 12 Y3 (out), 13 Y2 (out), 14 Y1 (out), 15 Y0 (out)

## 74*238N
designator V?, comment 1 of 8 noninverting DECODER/DEMULTIPLEXER
footprint DIL16
part A pins: 16 +UB (power)
part B pins: 8 -UB (power)
part C pins: 1 A, 2 B, 3 C, 4 !G2A, 5 !G2B, 6 G1, 7 Y7 (out), 9 Y6 (out), 10 Y5 (out), 11 Y4 (out), 12 Y3 (out), 13 Y2 (out), 14 Y1 (out), 15 Y0 (out)

## 74*239N
designator V?, comment Dual 1 of 4 noninverting DECODER/DEMULTIPLEXER
footprint DIL16
part A pins: 16 +UB (power)
part B pins: 8 -UB (power)
part C pins: 1 !G, 2 A, 3 B, 4 Y0 (out), 5 Y1 (out), 6 Y2 (out), 7 Y3 (out)
part D pins: 9 Y3 (out), 10 Y2 (out), 11 Y1 (out), 12 Y0 (out), 13 B, 14 A, 15 !G

## 74*240N
designator V?, comment Octal BUFFER and LINE DRIVER, 3-state
footprint DIL20
part A pins: 20 +UB (power)
part B pins: 10 -UB (power)
part C pins: 1 !G, 2 A1, 4 A2, 6 A3, 8 A4, 12 Y4 (hiz), 14 Y3 (hiz), 16 Y2 (hiz), 18 Y1 (hiz)
part D pins: 3 Y4 (hiz), 5 Y3 (hiz), 7 Y2 (hiz), 9 Y1 (hiz), 11 A1, 13 A2, 15 A3, 17 A4, 19 !G

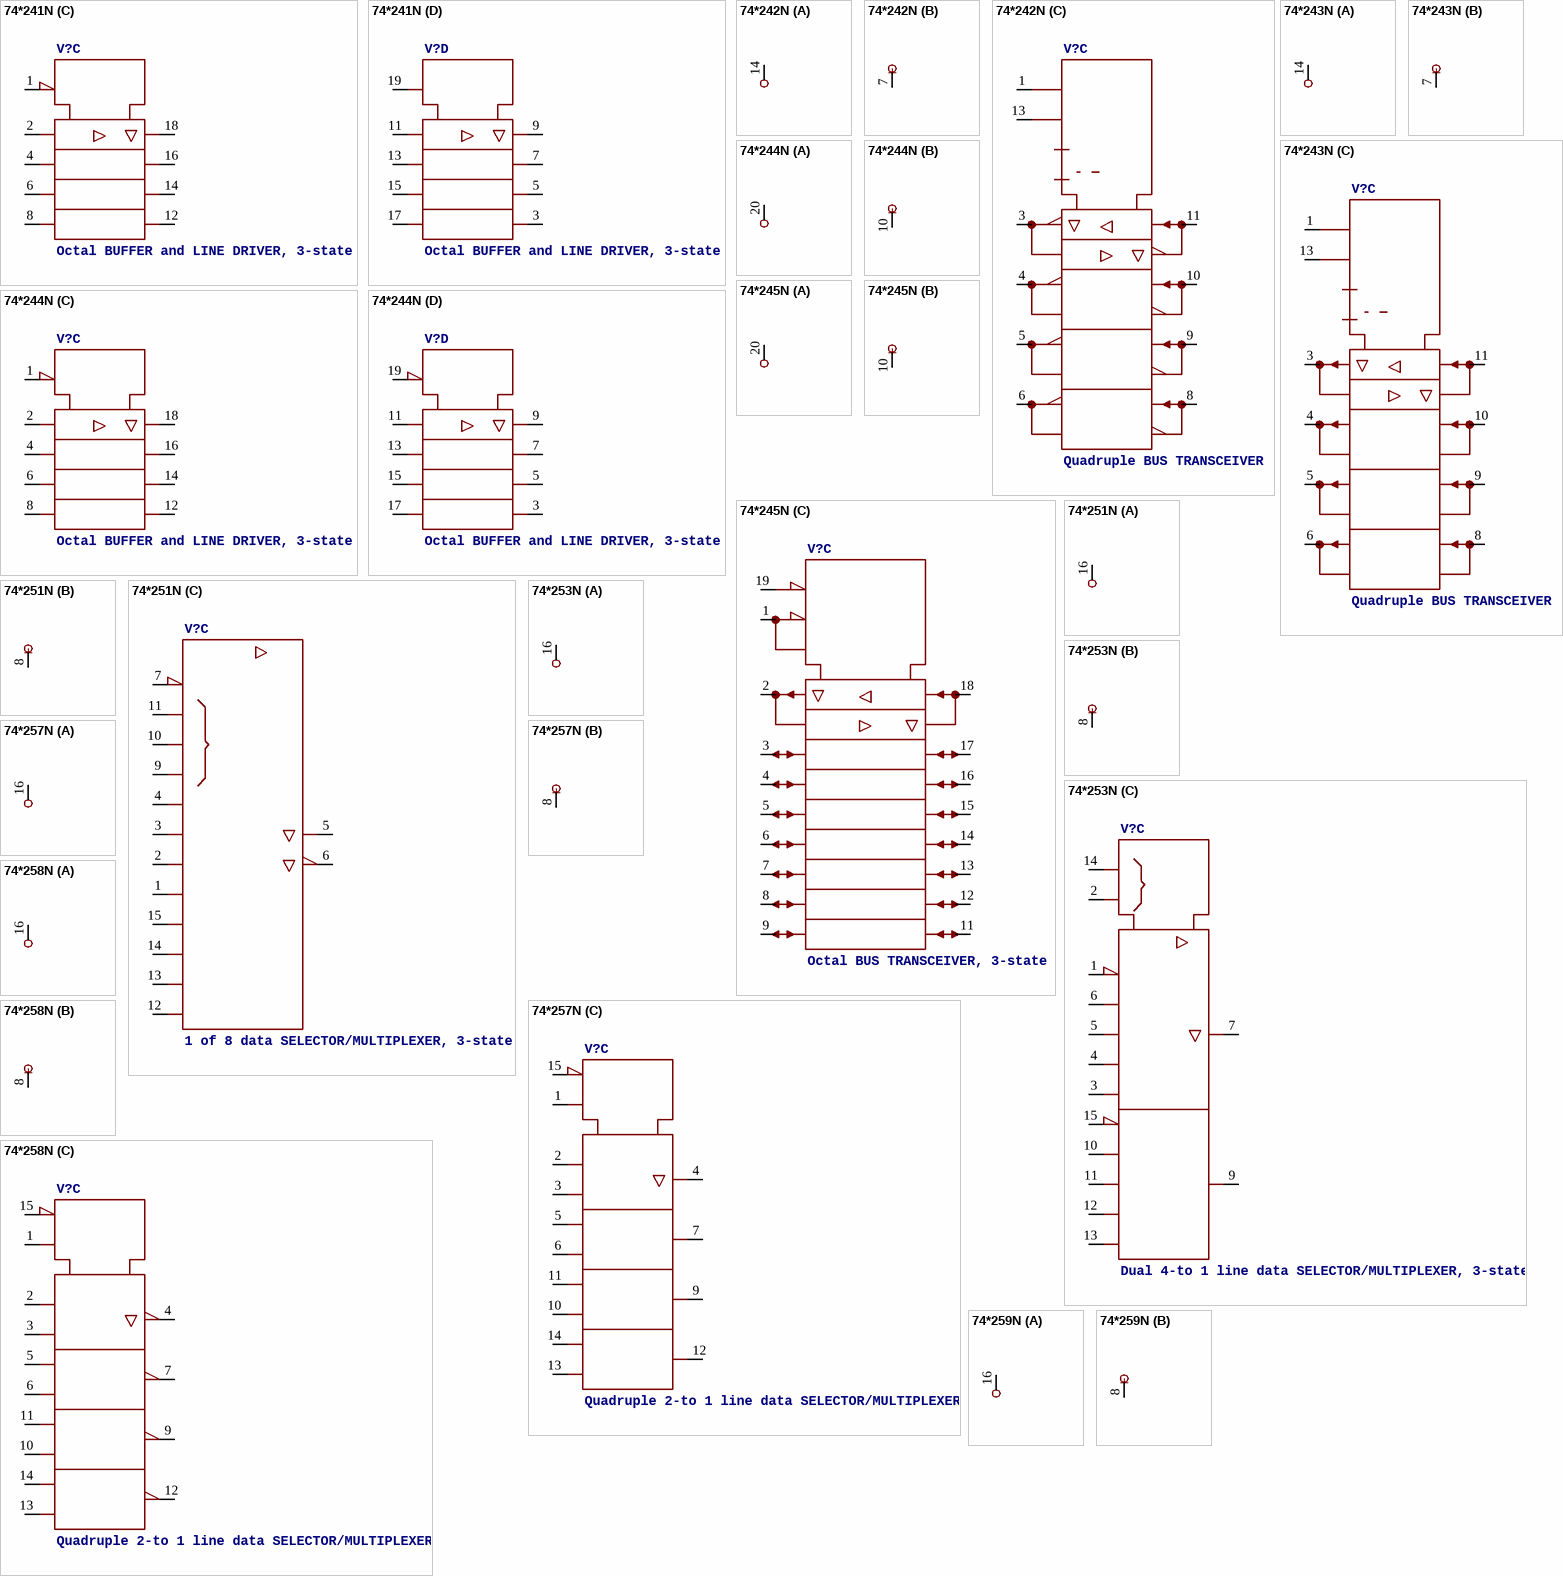
[diagram p8: symbols 74*241N to 74*259N]

## 74*241N
designator V?, comment Octal BUFFER and LINE DRIVER, 3-state
footprint DIL20
part A pins: 20 +UB (power)
part B pins: 10 -UB (power)
part C pins: 1 !G, 2 A1, 4 A2, 6 A3, 8 A4, 12 Y4 (hiz), 14 Y3 (hiz), 16 Y2 (hiz), 18 Y1 (hiz)
part D pins: 3 Y4 (hiz), 5 Y3 (hiz), 7 Y2 (hiz), 9 Y1 (hiz), 11 A1, 13 A2, 15 A3, 17 A4, 19 G

## 74*242N
designator V?, comment Quadruple BUS TRANSCEIVER
footprint DIL14
part A pins: 14 +UB (power)
part B pins: 7 -UB (power)
part C pins: 1 G1, 3 A1, 4 A2, 5 A3, 6 A4, 8 B4, 9 B3, 10 B2, 11 B1, 13 G2

## 74*243N
designator V?, comment Quadruple BUS TRANSCEIVER
footprint DIL14
part A pins: 14 +UB (power)
part B pins: 7 -UB (power)
part C pins: 1 G1, 3 A1, 4 A2, 5 A3, 6 A4, 8 B4, 9 B3, 10 B2, 11 B1, 13 G2

## 74*244N
designator V?, comment Octal BUFFER and LINE DRIVER, 3-state
footprint DIL20
part A pins: 20 +UB (power)
part B pins: 10 -UB (power)
part C pins: 1 !G, 2 A1, 4 A2, 6 A3, 8 A4, 12 Y4 (hiz), 14 Y3 (hiz), 16 Y2 (hiz), 18 Y1 (hiz)
part D pins: 3 Y4 (hiz), 5 Y3 (hiz), 7 Y2 (hiz), 9 Y1 (hiz), 11 A1, 13 A2, 15 A3, 17 A4, 19 !G

## 74*245N
designator V?, comment Octal BUS TRANSCEIVER, 3-state
footprint DIL20
part A pins: 20 +UB (power)
part B pins: 10 -UB (power)
part C pins: 1 DIR, 2 A1, 3 A2, 4 A3, 5 A4, 6 A5, 7 A6, 8 A7, 9 A8, 11 B8, 12 B7, 13 B6, 14 B5, 15 B4, 16 B3, 17 B2, 18 B1, 19 !G

## 74*251N
designator V?, comment 1 of 8 data SELECTOR/MULTIPLEXER, 3-state
footprint DIL16
part A pins: 16 +UB (power)
part B pins: 8 -UB (power)
part C pins: 1 D3, 2 D2, 3 D1, 4 D0, 5 Y (hiz), 6 W (hiz), 7 !G, 9 C, 10 B, 11 A, 12 D7, 13 D6, 14 D5, 15 D4

## 74*253N
designator V?, comment Dual 4-to 1 line data SELECTOR/MULTIPLEXER, 3-state
footprint DIL16
part A pins: 16 +UB (power)
part B pins: 8 -UB (power)
part C pins: 1 !1G, 2 B, 3 1C3, 4 1C2, 5 1C1, 6 1C0, 7 1Y (hiz), 9 2Y (hiz), 10 2C0, 11 2C1, 12 2C2, 13 2C3, 14 A, 15 !2G

## 74*257N
designator V?, comment Quadruple 2-to 1 line data SELECTOR/MULTIPLEXER
footprint DIL16
part A pins: 16 +UB (power)
part B pins: 8 -UB (power)
part C pins: 1 !A!/B, 2 1A, 3 1B, 4 1Y (hiz), 5 2A, 6 2B, 7 2Y (hiz), 9 3Y (hiz), 10 3B, 11 3A, 12 4Y (hiz), 13 4B, 14 4A, 15 !G

## 74*258N
designator V?, comment Quadruple 2-to 1 line data SELECTOR/MULTIPLEXER
footprint DIL16
part A pins: 16 +UB (power)
part B pins: 8 -UB (power)
part C pins: 1 A/!B, 2 1A, 3 1B, 4 1Y (hiz), 5 2A, 6 2B, 7 2Y (hiz), 9 3Y (hiz), 10 3B, 11 3A, 12 4Y (hiz), 13 4B, 14 4A, 15 !G

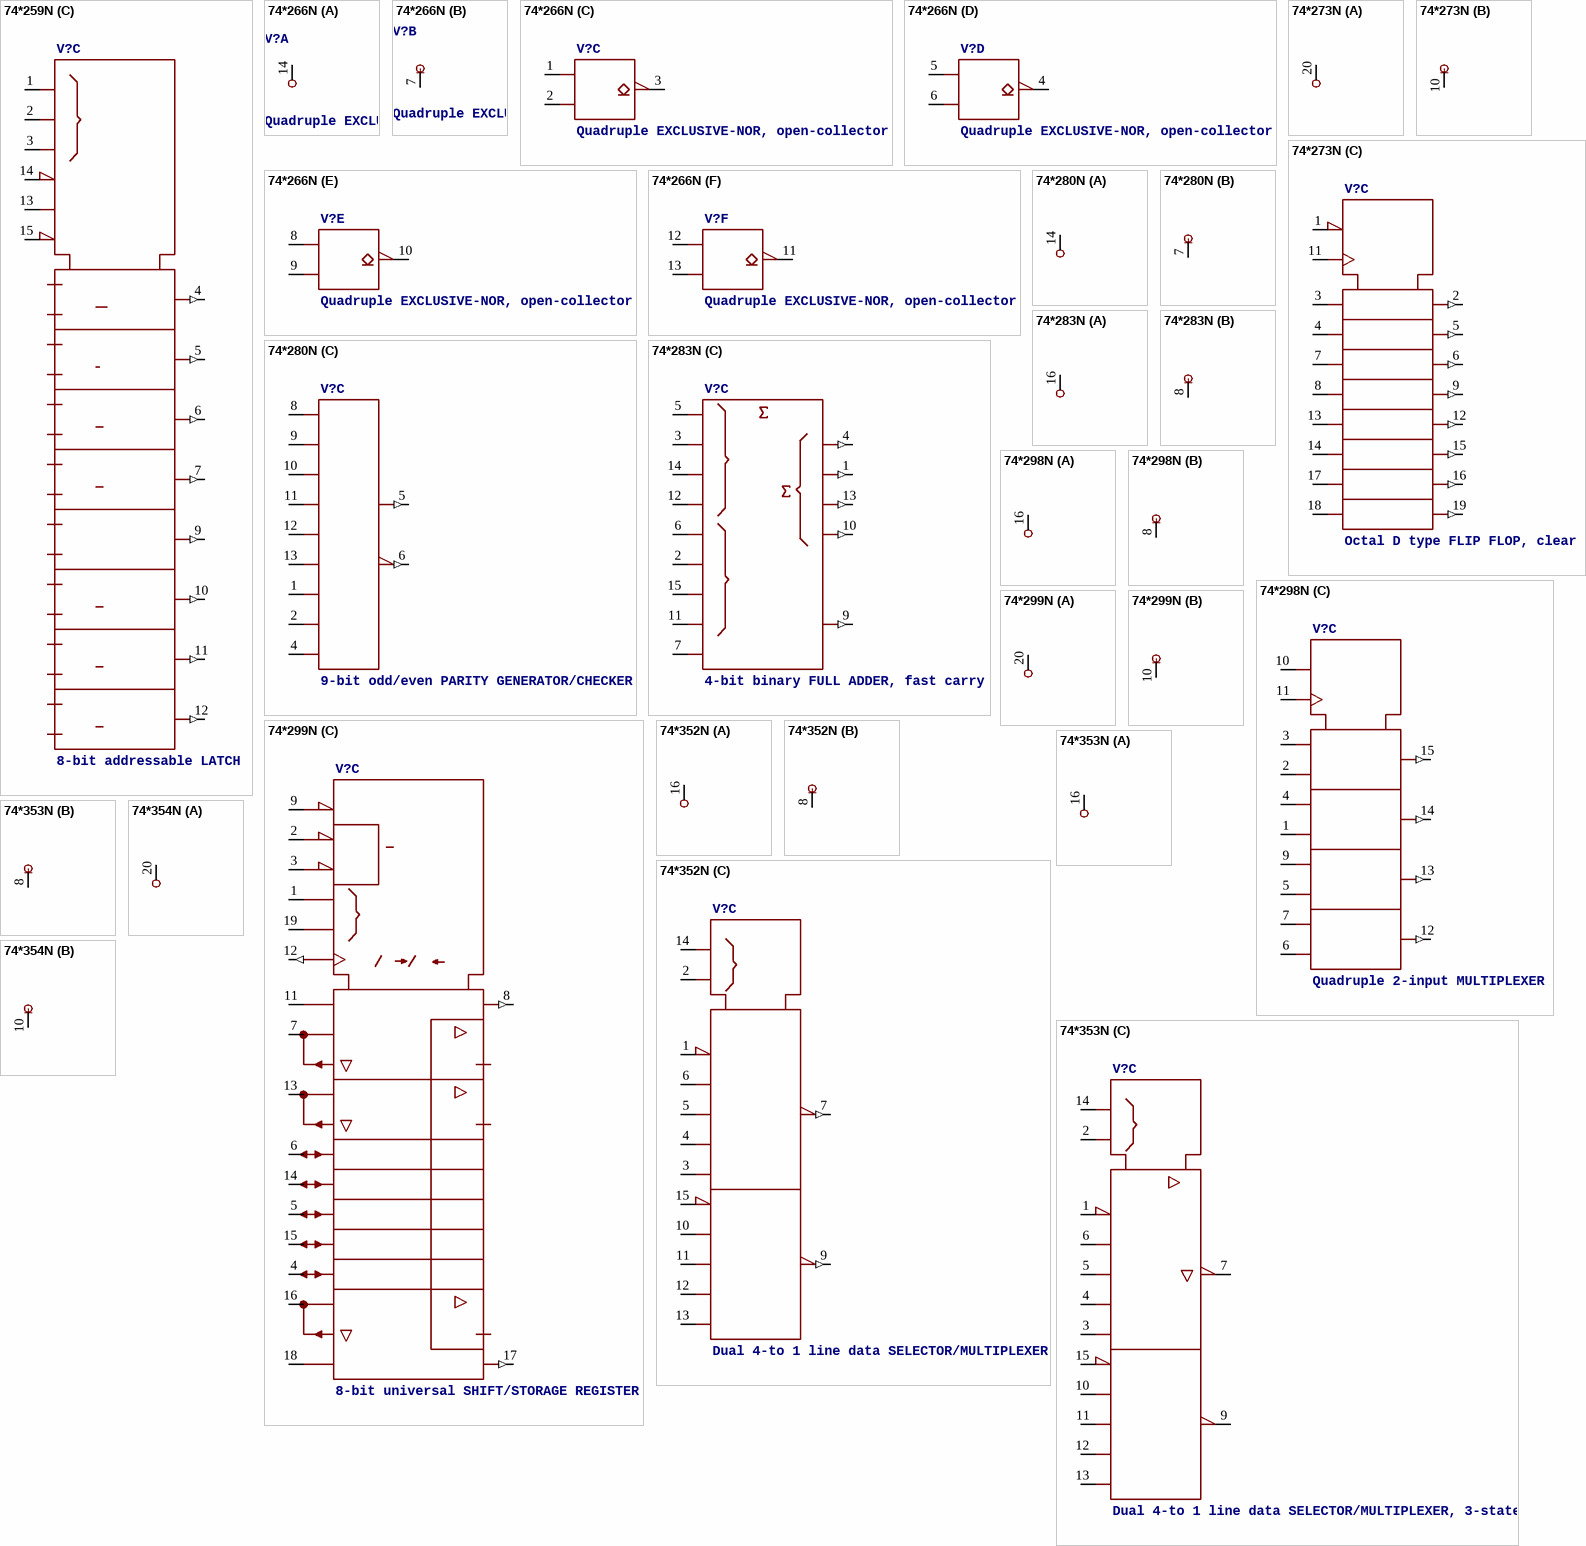
[diagram p9: symbols 74*259N to 74*354N]

## 74*259N
designator V?, comment 8-bit addressable LATCH
footprint DIL16
part A pins: 16 +UB (power)
part B pins: 8 -UB (power)
part C pins: 1 S0, 2 S1, 3 S2, 4 Q0 (out), 5 Q1 (out), 6 Q2 (out), 7 Q3 (out), 9 Q4 (out), 10 Q5 (out), 11 Q6 (out), 12 Q7 (out), 13 D, 14 !G, 15 !CLR

## 74*266N
designator V?, comment Quadruple EXCLUSIVE-NOR, open-collector
footprint DIL14
part A pins: 14 +UB (power)
part B pins: 7 -UB (power)
part C pins: 1 A, 2 B, 3 Y (oc)
part D pins: 4 Y (oc), 5 A, 6 B
part E pins: 8 A, 9 B, 10 Y (oc)
part F pins: 11 Y (oc), 12 A, 13 B

## 74*273N
designator V?, comment Octal D type FLIP FLOP, clear
footprint DIL20
part A pins: 20 +UB (power)
part B pins: 10 -UB (power)
part C pins: 1 !CLR, 2 1Q (out), 3 1D, 4 2D, 5 2Q (out), 6 3Q (out), 7 3D, 8 4D, 9 4Q (out), 11 CLK, 12 5Q (out), 13 5D, 14 6D, 15 6Q (out), 16 7Q (out), 17 7D, 18 8D, 19 8Q (out)

## 74*280N
designator V?, comment 9-bit odd/even PARITY GENERATOR/CHECKER
footprint DIL14
part A pins: 14 +UB (power)
part B pins: 7 -UB (power)
part C pins: 1 G, 2 H, 4 I, 5 SEVEN (out), 6 SODD (out), 8 A, 9 B, 10 C, 11 D, 12 E, 13 F

## 74*283N
designator V?, comment 4-bit binary FULL ADDER, fast carry
footprint DIL16
part A pins: 16 +UB (power)
part B pins: 8 -UB (power)
part C pins: 1 S2 (out), 2 B2, 3 A2, 4 S1 (out), 5 A1, 6 B1, 7 C0, 9 C4 (out), 10 S4 (out), 11 B4, 12 A4, 13 S3 (out), 14 A3, 15 B3

## 74*298N
designator V?, comment Quadruple 2-input MULTIPLEXER
footprint DIL16
part A pins: 16 +UB (power)
part B pins: 8 -UB (power)
part C pins: 1 B2, 2 A2, 3 A1, 4 B1, 5 C2, 6 D2, 7 D1, 9 C1, 10 WS, 11 CLK, 12 QD (out), 13 QC (out), 14 QB (out), 15 QA (out)

## 74*299N
designator V?, comment 8-bit universal SHIFT/STORAGE REGISTER
footprint DIL20
part A pins: 20 +UB (power)
part B pins: 10 -UB (power)
part C pins: 1 S0, 2 !G1, 3 !G2, 4 G/QG, 5 E/QE, 6 C/QC, 7 A/QA, 8 QA* (out), 9 !CLR, 11 SR, 12 CLK (out), 13 B/QB, 14 D/QD, 15 F/QF, 16 H/QH, 17 QH* (out), 18 SL, 19 S1

## 74*352N
designator V?, comment Dual 4-to 1 line data SELECTOR/MULTIPLEXER
footprint DIL16
part A pins: 16 +UB (power)
part B pins: 8 -UB (power)
part C pins: 1 !1G, 2 B, 3 1C3, 4 1C2, 5 1C1, 6 1C0, 7 1Y (out), 9 2Y (out), 10 2C0, 11 2C1, 12 2C2, 13 2C3, 14 A, 15 !2G

## 74*353N
designator V?, comment Dual 4-to 1 line data SELECTOR/MULTIPLEXER, 3-state
footprint DIL16
part A pins: 16 +UB (power)
part B pins: 8 -UB (power)
part C pins: 1 !1G, 2 B, 3 1C3, 4 1C2, 5 1C1, 6 1C0, 7 1Y (hiz), 9 2Y (hiz), 10 2C0, 11 2C1, 12 2C2, 13 2C3, 14 A, 15 !2G

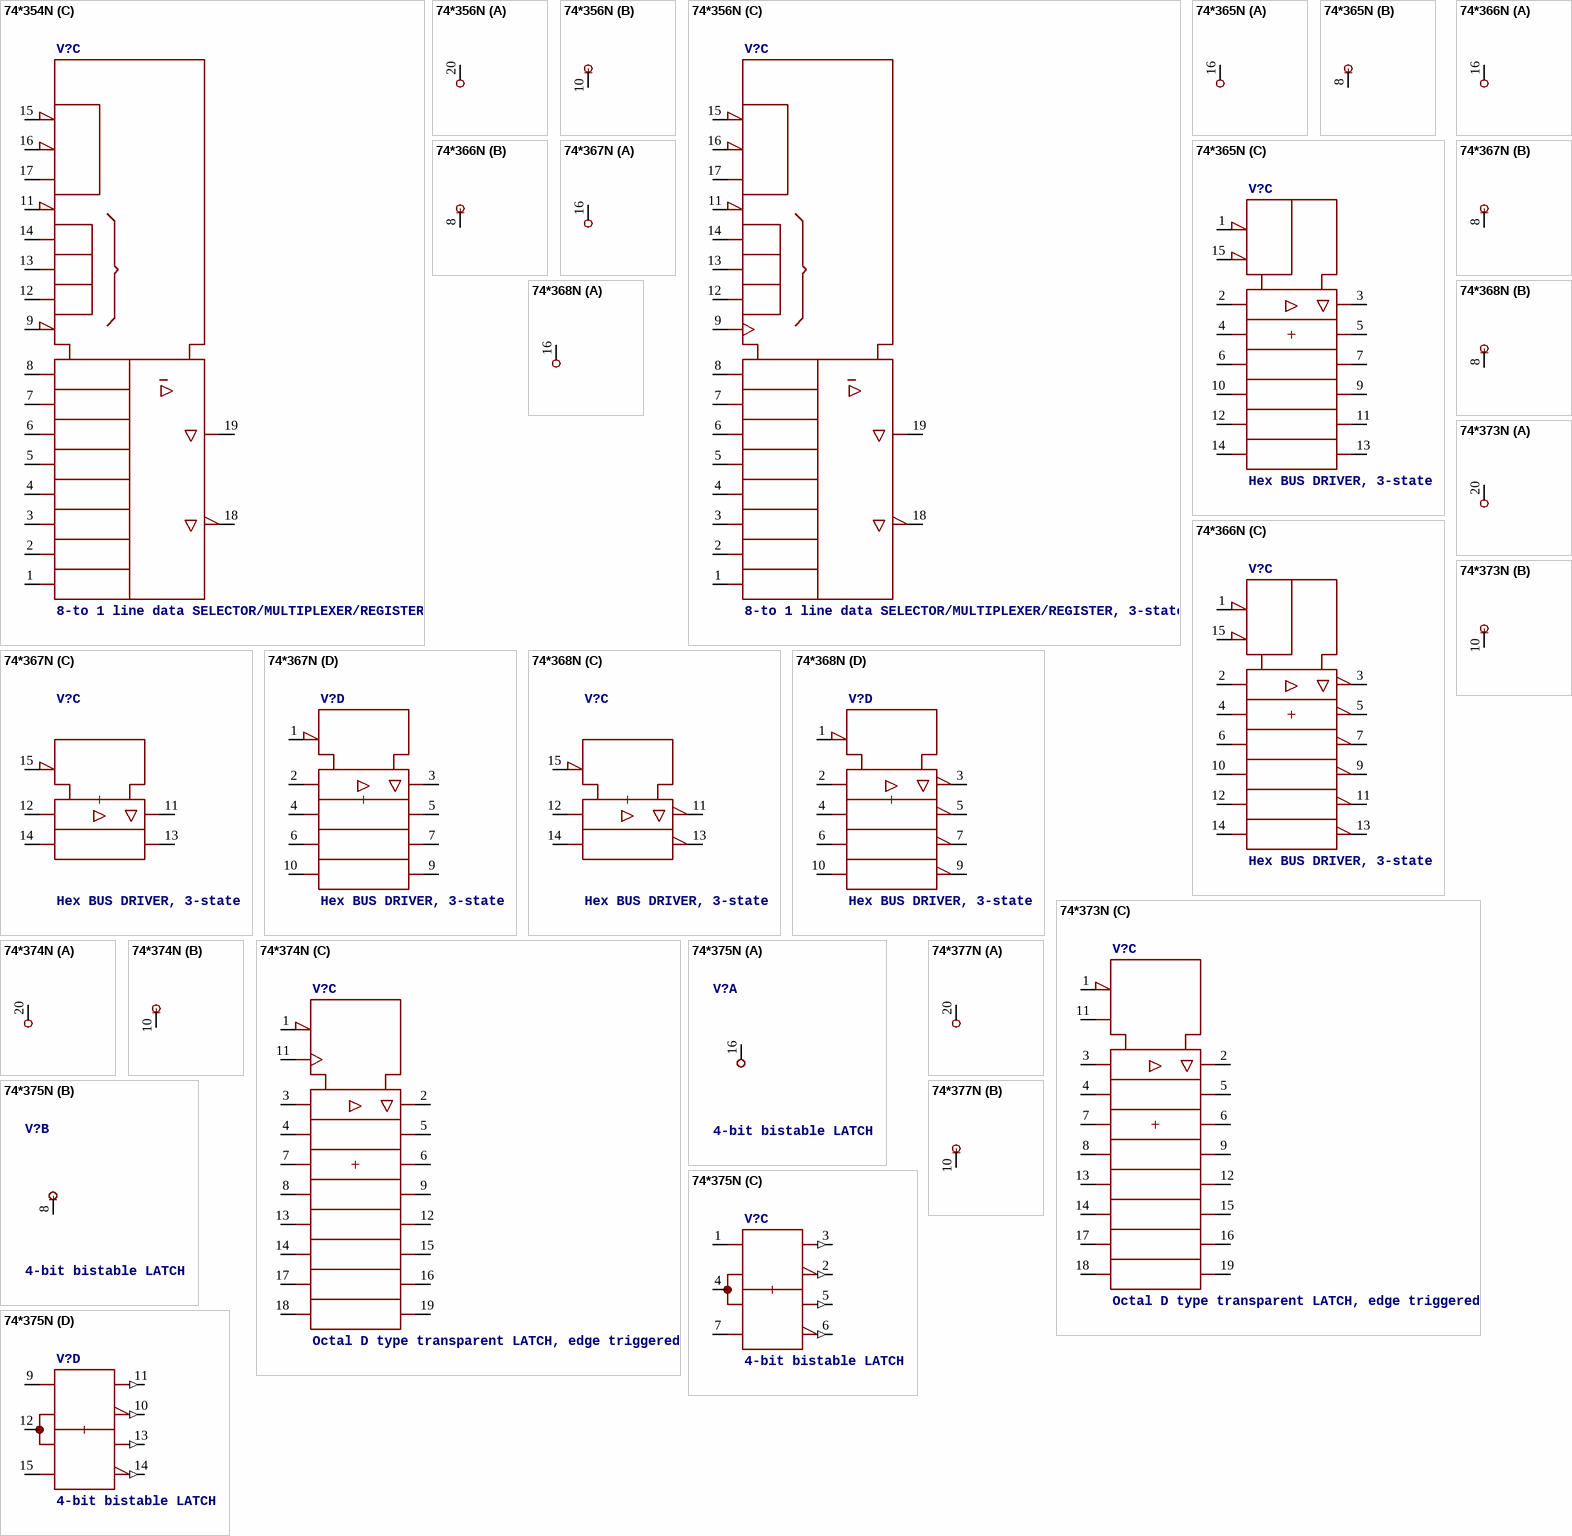
[diagram p10: symbols 74*354N to 74*377N]

## 74*354N
designator V?, comment 8-to 1 line data SELECTOR/MULTIPLEXER/REGISTER
footprint DIL20
part A pins: 20 +UB (power)
part B pins: 10 -UB (power)
part C pins: 1 D7, 2 D6, 3 D5, 4 D4, 5 D3, 6 D2, 7 D1, 8 D0, 9 !DC, 11 !SC, 12 S2, 13 S1, 14 S0, 15 !G1, 16 !G2, 17 G3, 18 W (hiz), 19 Y (hiz)

## 74*356N
designator V?, comment 8-to 1 line data SELECTOR/MULTIPLEXER/REGISTER, 3-state
footprint DIL20
part A pins: 20 +UB (power)
part B pins: 10 -UB (power)
part C pins: 1 D7, 2 D6, 3 D5, 4 D4, 5 D3, 6 D2, 7 D1, 8 D0, 9 CLK, 11 !SC, 12 S2, 13 S1, 14 S0, 15 !G1, 16 !G2, 17 G3, 18 W (hiz), 19 Y (hiz)

## 74*365N
designator V?, comment Hex BUS DRIVER, 3-state
footprint DIL16
part A pins: 16 +UB (power)
part B pins: 8 -UB (power)
part C pins: 1 !G1, 2 A1, 3 Y1 (hiz), 4 A2, 5 Y2 (hiz), 6 A3, 7 Y3 (hiz), 9 Y4 (hiz), 10 A4, 11 Y5 (hiz), 12 A5, 13 Y6 (hiz), 14 A6, 15 !G2

## 74*366N
designator V?, comment Hex BUS DRIVER, 3-state
footprint DIL16
part A pins: 16 +UB (power)
part B pins: 8 -UB (power)
part C pins: 1 !G1, 2 A1, 3 Y1 (hiz), 4 A2, 5 Y2 (hiz), 6 A3, 7 Y3 (hiz), 9 Y4 (hiz), 10 A4, 11 Y5 (hiz), 12 A5, 13 Y6 (hiz), 14 A6, 15 !G2

## 74*367N
designator V?, comment Hex BUS DRIVER, 3-state
footprint DIL16
part A pins: 16 +UB (power)
part B pins: 8 -UB (power)
part C pins: 11 Y1 (hiz), 12 A1, 13 Y2 (hiz), 14 A2, 15 !G
part D pins: 1 !G, 2 A1, 3 Y1 (hiz), 4 A2, 5 Y2 (hiz), 6 A3, 7 Y3 (hiz), 9 Y4 (hiz), 10 A4

## 74*368N
designator V?, comment Hex BUS DRIVER, 3-state
footprint DIL16
part A pins: 16 +UB (power)
part B pins: 8 -UB (power)
part C pins: 11 Y1 (hiz), 12 A1, 13 Y2 (hiz), 14 A2, 15 !G
part D pins: 1 !G, 2 A1, 3 Y1 (hiz), 4 A2, 5 Y2 (hiz), 6 A3, 7 Y3 (hiz), 9 Y4 (hiz), 10 A4

## 74*373N
designator V?, comment Octal D type transparent LATCH, edge triggered
footprint DIL20
part A pins: 20 +UB (power)
part B pins: 10 -UB (power)
part C pins: 1 !OC, 2 1Q (hiz), 3 1D, 4 2D, 5 2Q (hiz), 6 3Q (hiz), 7 3D, 8 4D, 9 4Q (hiz), 11 C, 12 5Q (hiz), 13 5D, 14 6D, 15 6Q (hiz), 16 7Q (hiz), 17 7D, 18 8D, 19 8Q (hiz)

## 74*374N
designator V?, comment Octal D type transparent LATCH, edge triggered
footprint DIL20
part A pins: 20 +UB (power)
part B pins: 10 -UB (power)
part C pins: 1 !OC, 2 1Q (hiz), 3 1D, 4 2D, 5 2Q (hiz), 6 3Q (hiz), 7 3D, 8 4D, 9 4Q (hiz), 11 CLK, 12 5Q (hiz), 13 5D, 14 6D, 15 6Q (hiz), 16 7Q (hiz), 17 7D, 18 8D, 19 8Q (hiz)

## 74*375N
designator V?, comment 4-bit bistable LATCH
footprint DIL16
part A pins: 16 +UB (power)
part B pins: 8 -UB (power)
part C pins: 1 1D, 2 !1Q (out), 3 1Q (out), 4 1C,2C, 5 2Q (out), 6 !2Q (out), 7 2D
part D pins: 9 1D, 10 !1Q (out), 11 1Q (out), 12 1C,2C, 13 2Q (out), 14 !2Q (out), 15 2D

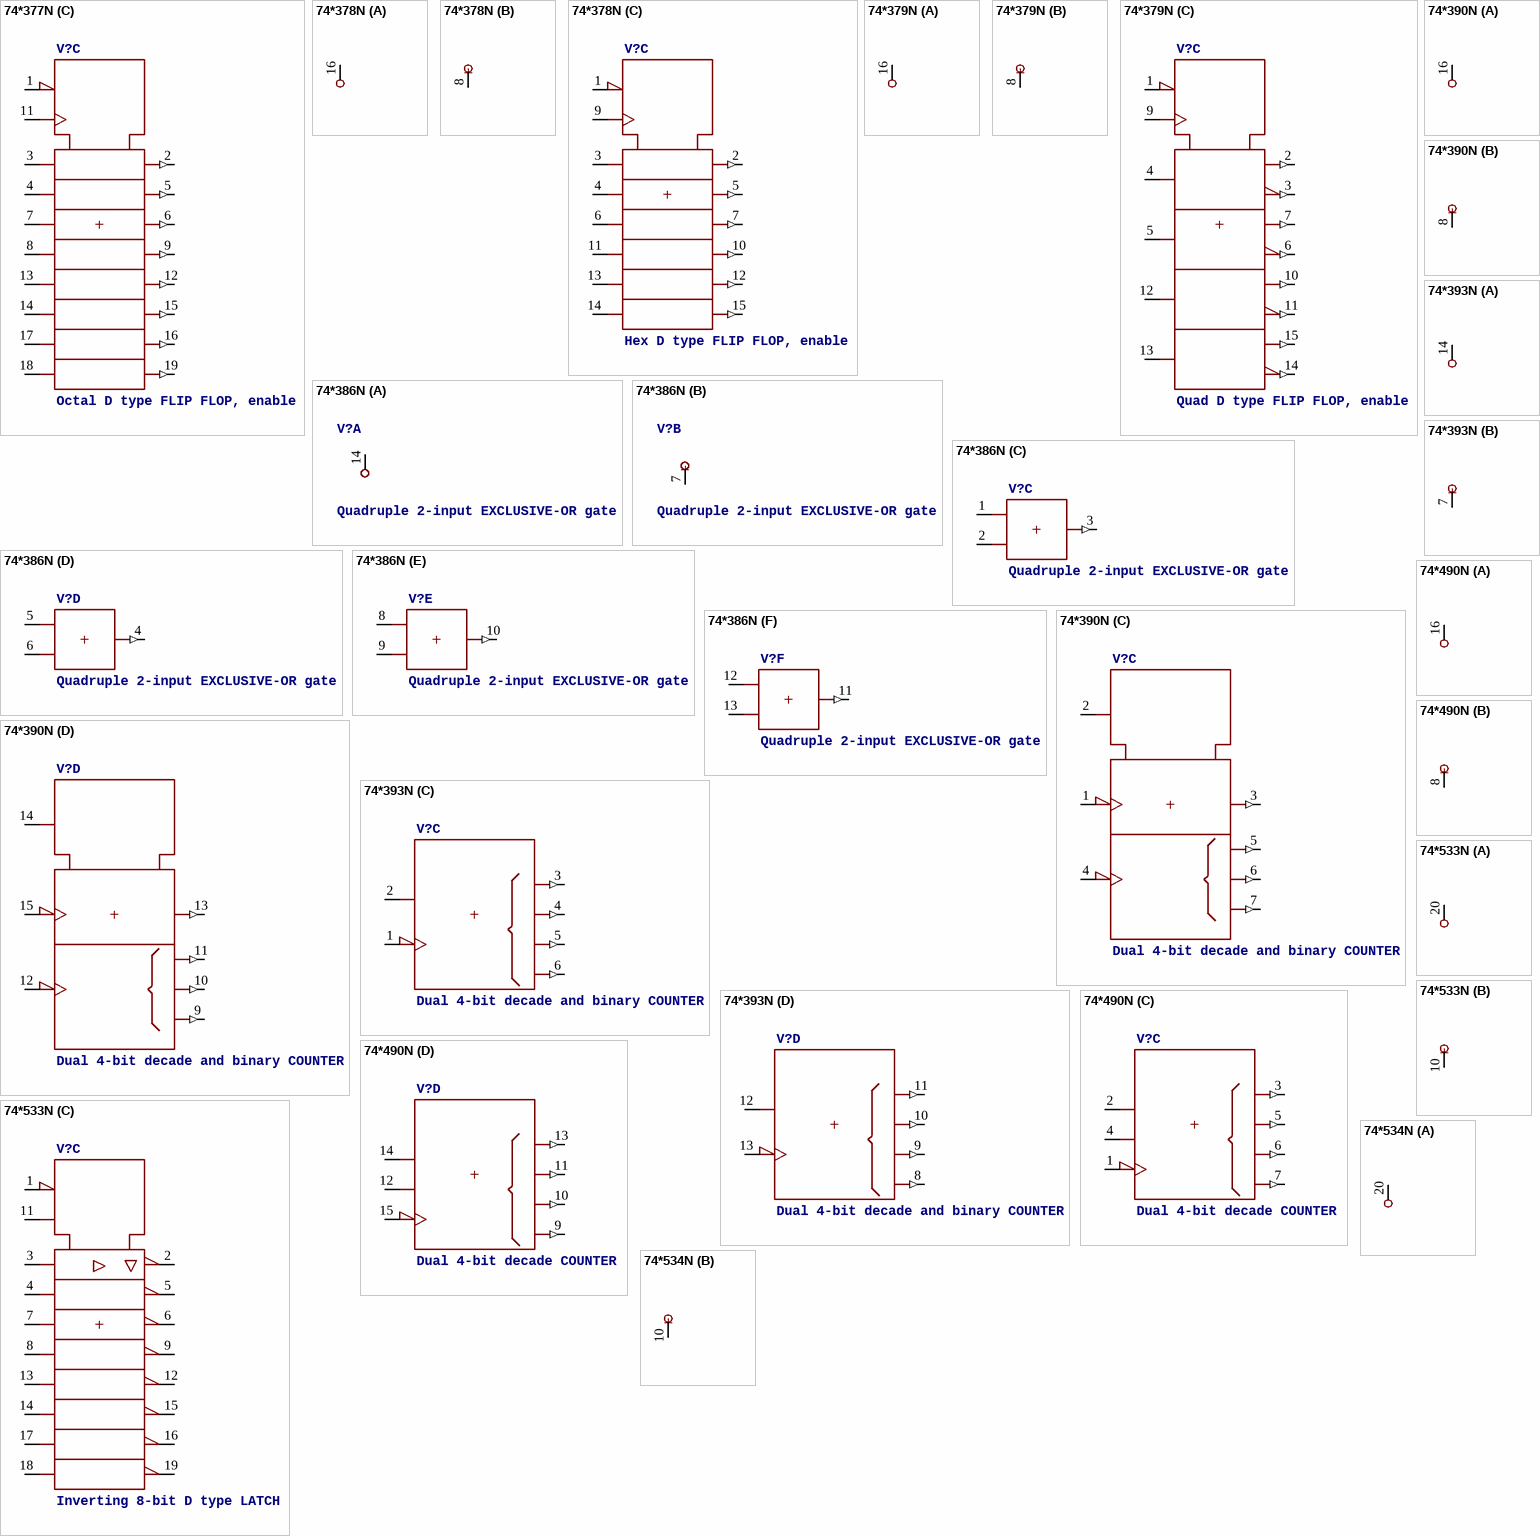
[diagram p11: symbols 74*377N to 74*534N]

## 74*377N
designator V?, comment Octal D type FLIP FLOP, enable
footprint DIL20
part A pins: 20 +UB (power)
part B pins: 10 -UB (power)
part C pins: 1 !G, 2 1Q (out), 3 1D, 4 2D, 5 2Q (out), 6 3Q (out), 7 3D, 8 4D, 9 4Q (out), 11 CLK, 12 5Q (out), 13 5D, 14 6D, 15 6Q (out), 16 7Q (out), 17 7D, 18 8D, 19 8Q (out)

## 74*378N
designator V?, comment Hex D type FLIP FLOP, enable
footprint DIL16
part A pins: 16 +UB (power)
part B pins: 8 -UB (power)
part C pins: 1 !G, 2 1Q (out), 3 1D, 4 2D, 5 2Q (out), 6 3D, 7 3Q (out), 9 CLK, 10 4Q (out), 11 4D, 12 5Q (out), 13 5D, 14 6D, 15 6Q (out)

## 74*379N
designator V?, comment Quad D type FLIP FLOP, enable
footprint DIL16
part A pins: 16 +UB (power)
part B pins: 8 -UB (power)
part C pins: 1 !G, 2 1Q (out), 3 !1Q (out), 4 1D, 5 2D, 6 !2Q (out), 7 2Q (out), 9 CLK, 10 3Q (out), 11 !3Q (out), 12 3D, 13 4D, 14 !4Q (out), 15 4Q (out)

## 74*386N
designator V?, comment Quadruple 2-input EXCLUSIVE-OR gate
footprint DIL14
part A pins: 14 +UB (power)
part B pins: 7 -UB (power)
part C pins: 1 A, 2 B, 3 Y (out)
part D pins: 4 Y (out), 5 A, 6 B
part E pins: 8 A, 9 B, 10 Y (out)
part F pins: 11 Y (out), 12 A, 13 B

## 74*390N
designator V?, comment Dual 4-bit decade and binary COUNTER
footprint DIL16
part A pins: 16 +UB (power)
part B pins: 8 -UB (power)
part C pins: 1 CKA, 2 CLR, 3 QA (out), 4 CKB, 5 QB (out), 6 QC (out), 7 QD (out)
part D pins: 9 QD (out), 10 QC (out), 11 QB (out), 12 CKB, 13 QA (out), 14 CLR, 15 CKA

## 74*393N
designator V?, comment Dual 4-bit decade and binary COUNTER
footprint DIL14
part A pins: 14 +UB (power)
part B pins: 7 -UB (power)
part C pins: 1 A, 2 CLR, 3 QA (out), 4 QB (out), 5 QC (out), 6 QD (out)
part D pins: 8 QD (out), 9 QC (out), 10 QB (out), 11 QA (out), 12 CLR, 13 A

## 74*490N
designator V?, comment Dual 4-bit decade COUNTER
footprint DIL16
part A pins: 16 +UB (power)
part B pins: 8 -UB (power)
part C pins: 1 CLK, 2 CLR, 3 QA (out), 4 SET9, 5 QB (out), 6 QC (out), 7 QD (out)
part D pins: 9 QD (out), 10 QC (out), 11 QB (out), 12 SET9, 13 QA (out), 14 CLR, 15 CLK

## 74*533N
designator V?, comment Inverting 8-bit D type LATCH
footprint DIL20
part A pins: 20 +UB (power)
part B pins: 10 -UB (power)
part C pins: 1 !OC, 2 !1Q (hiz), 3 1D, 4 2D, 5 !2Q (hiz), 6 !3Q (hiz), 7 3D, 8 4D, 9 !4Q (hiz), 11 C, 12 !5Q (hiz), 13 5D, 14 6D, 15 !6Q (hiz), 16 !7Q (hiz), 17 7D, 18 8D, 19 !8Q (hiz)

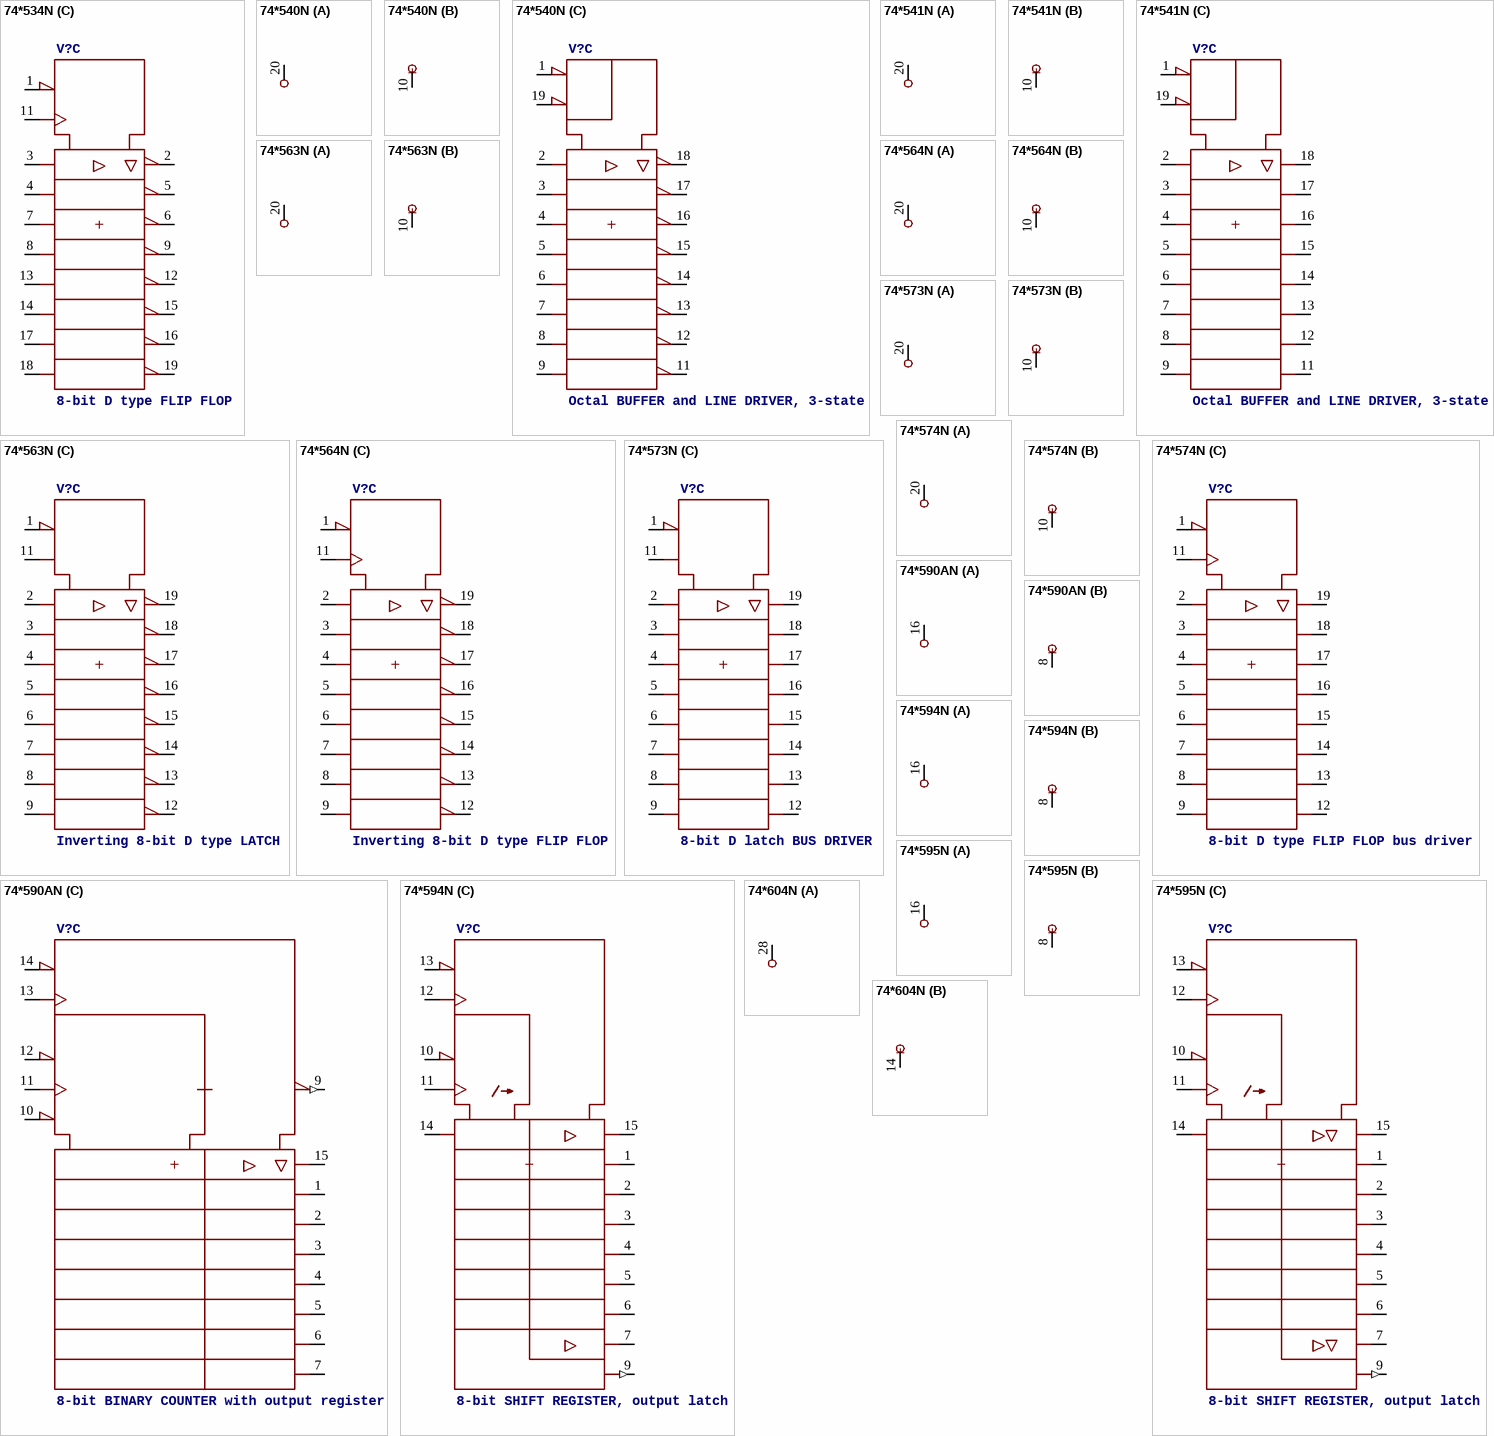
[diagram p12: symbols 74*534N to 74*604N]

## 74*534N
designator V?, comment 8-bit D type FLIP FLOP
footprint DIL20
part A pins: 20 +UB (power)
part B pins: 10 -UB (power)
part C pins: 1 !OC, 2 !1Q (hiz), 3 1D, 4 2D, 5 !2Q (hiz), 6 !3Q (hiz), 7 3D, 8 4D, 9 !4Q (hiz), 11 CLK, 12 !5Q (hiz), 13 5D, 14 6D, 15 !6Q (hiz), 16 !7Q (hiz), 17 7D, 18 8D, 19 !8Q (hiz)

## 74*540N
designator V?, comment Octal BUFFER and LINE DRIVER, 3-state
footprint DIL20
part A pins: 20 +UB (power)
part B pins: 10 -UB (power)
part C pins: 1 !G1, 2 A1, 3 A2, 4 A3, 5 A4, 6 A5, 7 A6, 8 A7, 9 A8, 11 Y8 (hiz), 12 Y7 (hiz), 13 Y6 (hiz), 14 Y5 (hiz), 15 Y4 (hiz), 16 Y3 (hiz), 17 Y2 (hiz), 18 Y1 (hiz), 19 !G2

## 74*541N
designator V?, comment Octal BUFFER and LINE DRIVER, 3-state
footprint DIL20
part A pins: 20 +UB (power)
part B pins: 10 -UB (power)
part C pins: 1 !G1, 2 A1, 3 A2, 4 A3, 5 A4, 6 A5, 7 A6, 8 A7, 9 A8, 11 Y8 (hiz), 12 Y7 (hiz), 13 Y6 (hiz), 14 Y5 (hiz), 15 Y4 (hiz), 16 Y3 (hiz), 17 Y2 (hiz), 18 Y1 (hiz), 19 !G2

## 74*563N
designator V?, comment Inverting 8-bit D type LATCH
footprint DIL20
part A pins: 20 +UB (power)
part B pins: 10 -UB (power)
part C pins: 1 !OC, 2 1D, 3 2D, 4 3D, 5 4D, 6 5D, 7 6D, 8 7D, 9 8D, 11 C, 12 !8Q (hiz), 13 !7Q (hiz), 14 !6Q (hiz), 15 !5Q (hiz), 16 !4Q (hiz), 17 !3Q (hiz), 18 !2Q (hiz), 19 !1Q (hiz)

## 74*564N
designator V?, comment Inverting 8-bit D type FLIP FLOP
footprint DIL20
part A pins: 20 +UB (power)
part B pins: 10 -UB (power)
part C pins: 1 !OC, 2 1D, 3 2D, 4 3D, 5 4D, 6 5D, 7 6D, 8 7D, 9 8D, 11 CLK, 12 !8Q (hiz), 13 !7Q (hiz), 14 !6Q (hiz), 15 !5Q (hiz), 16 !4Q (hiz), 17 !3Q (hiz), 18 !2Q (hiz), 19 !1Q (hiz)

## 74*573N
designator V?, comment 8-bit D latch BUS DRIVER
footprint DIL20
part A pins: 20 +UB (power)
part B pins: 10 -UB (power)
part C pins: 1 !OC, 2 1D, 3 2D, 4 3D, 5 4D, 6 5D, 7 6D, 8 7D, 9 8D, 11 C, 12 8Q (hiz), 13 7Q (hiz), 14 6Q (hiz), 15 5Q (hiz), 16 4Q (hiz), 17 3Q (hiz), 18 2Q (hiz), 19 1Q (hiz)

## 74*574N
designator V?, comment 8-bit D type FLIP FLOP bus driver
footprint DIL20
part A pins: 20 +UB (power)
part B pins: 10 -UB (power)
part C pins: 1 !OC, 2 1D, 3 2D, 4 3D, 5 4D, 6 5D, 7 6D, 8 7D, 9 8D, 11 CLK, 12 8Q (hiz), 13 7Q (hiz), 14 6Q (hiz), 15 5Q (hiz), 16 4Q (hiz), 17 3Q (hiz), 18 2Q (hiz), 19 1Q (hiz)

## 74*590AN
designator V?, comment 8-bit BINARY COUNTER with output register
footprint DIL16
part A pins: 16 +UB (power)
part B pins: 8 -UB (power)
part C pins: 1 QB (hiz), 2 QC (hiz), 3 QD (hiz), 4 QE (hiz), 5 QF (hiz), 6 QG (hiz), 7 QH (hiz), 9 !RCO (out), 10 !CCLR, 11 CCK, 12 !CCKEN, 13 RCK, 14 !G, 15 QA (hiz)

## 74*594N
designator V?, comment 8-bit SHIFT REGISTER, output latch
footprint DIL16
part A pins: 16 +UB (power)
part B pins: 8 -UB (power)
part C pins: 1 QB (hiz), 2 QC (hiz), 3 QD (hiz), 4 QE (hiz), 5 QF (hiz), 6 QG (hiz), 7 QH (hiz), 9 QH* (out), 10 !SRCLR, 11 SRCK, 12 RCK, 13 !RCLR, 14 SER, 15 QA (hiz)

## 74*595N
designator V?, comment 8-bit SHIFT REGISTER, output latch
footprint DIL16
part A pins: 16 +UB (power)
part B pins: 8 -UB (power)
part C pins: 1 QB (hiz), 2 QC (hiz), 3 QD (hiz), 4 QE (hiz), 5 QF (hiz), 6 QG (hiz), 7 QH (hiz), 9 QH* (out), 10 !SRCLR, 11 SRCK, 12 RCK, 13 !G, 14 SER, 15 QA (hiz)

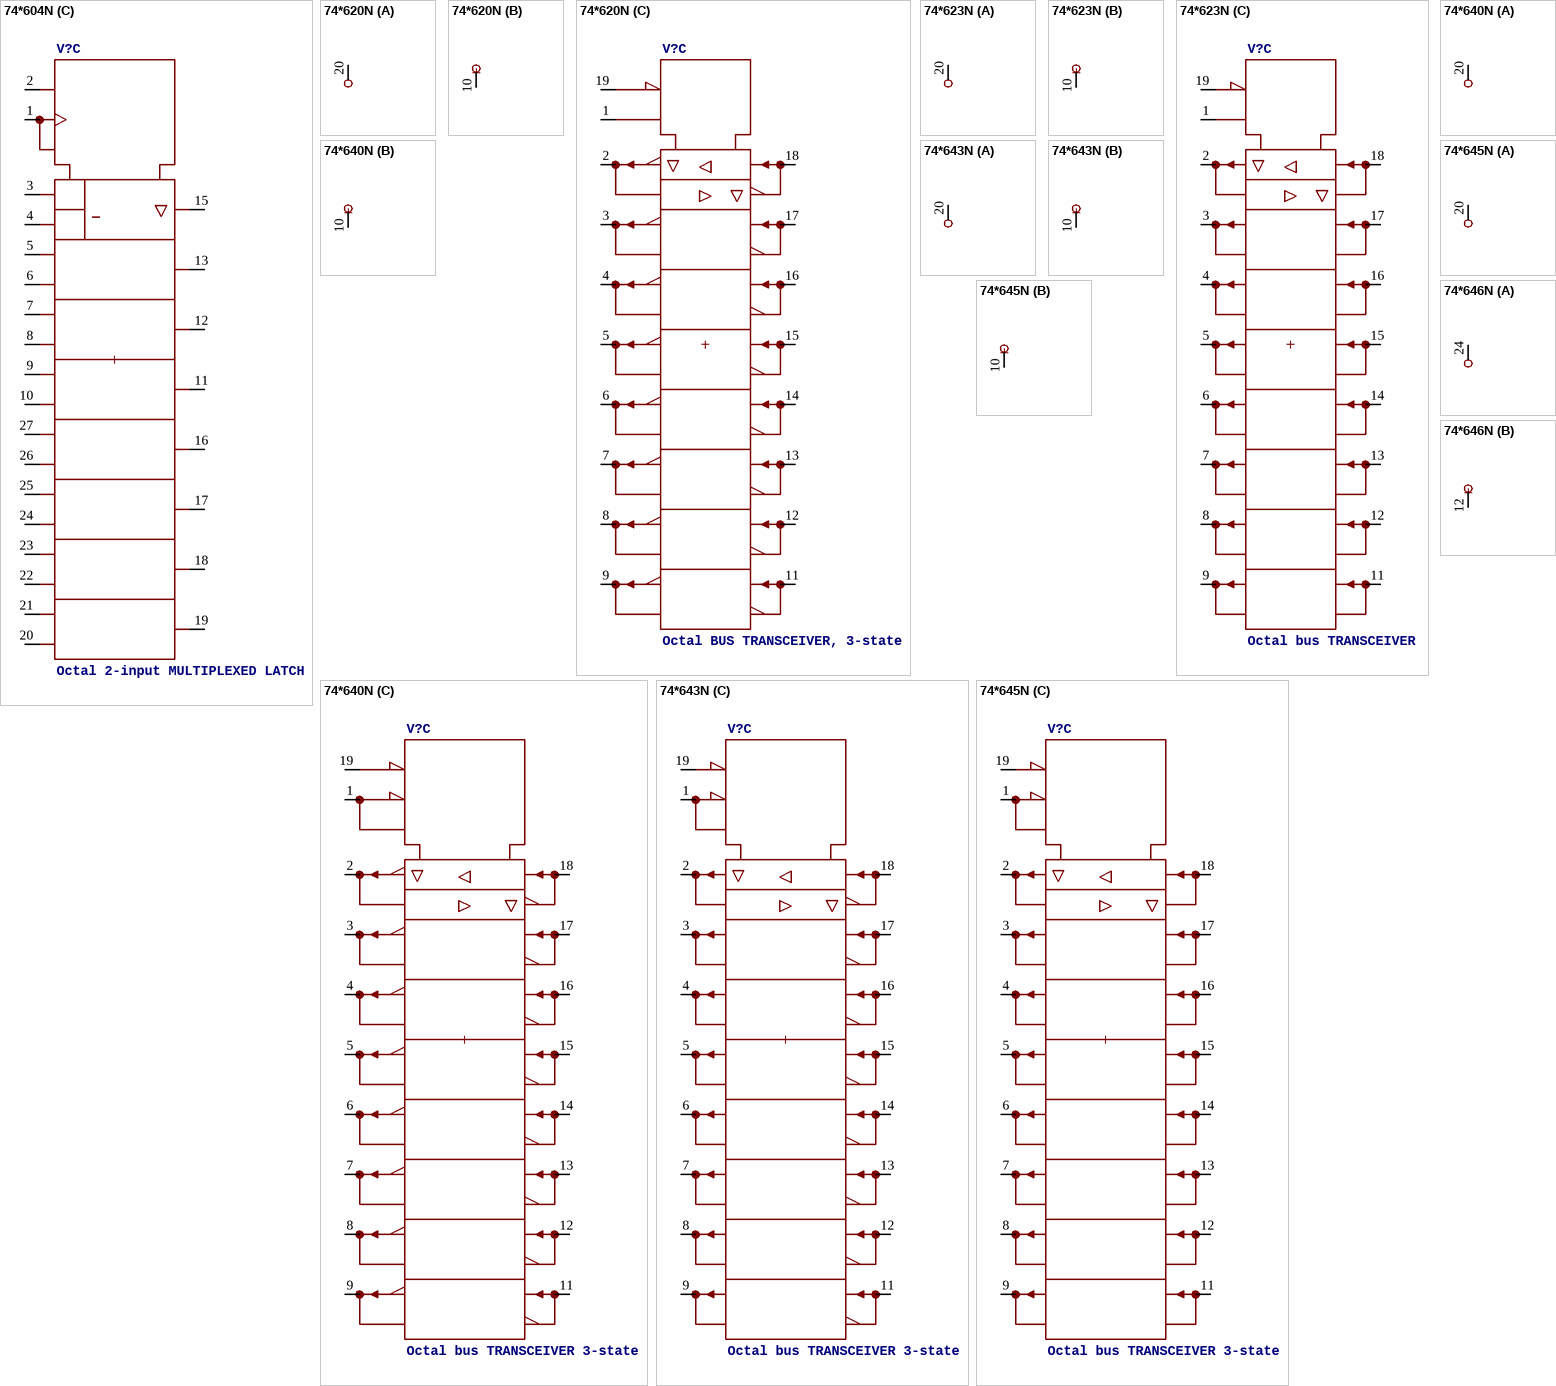
[diagram p13: symbols 74*604N to 74*646N]

## 74*604N
designator V?, comment Octal 2-input MULTIPLEXED LATCH
footprint DIL28-3
part A pins: 28 +UB (power)
part B pins: 14 -UB (power)
part C pins: 1 CLK, 2 SEL_A/!B, 3 A1, 4 B1, 5 A2, 6 B2, 7 A3, 8 B3, 9 A4, 10 B4, 11 Y4 (hiz), 12 Y3 (hiz), 13 Y2 (hiz), 15 Y1 (hiz), 16 Y5 (hiz), 17 Y6 (hiz), 18 Y7 (hiz), 19 Y8 (hiz), 20 B8, 21 A8, 22 B7, 23 A7, 24 B6, 25 A6, 26 B5, 27 A5

## 74*620N
designator V?, comment Octal BUS TRANSCEIVER, 3-state
footprint DIL20
part A pins: 20 +UB (power)
part B pins: 10 -UB (power)
part C pins: 1 GAB, 2 A1, 3 A2, 4 A3, 5 A4, 6 A5, 7 A6, 8 A7, 9 A8, 11 B8, 12 B7, 13 B6, 14 B5, 15 B4, 16 B3, 17 B2, 18 B1, 19 !GBA

## 74*623N
designator V?, comment Octal bus TRANSCEIVER
footprint DIL20
part A pins: 20 +UB (power)
part B pins: 10 -UB (power)
part C pins: 1 GAB, 2 A1, 3 A2, 4 A3, 5 A4, 6 A5, 7 A6, 8 A7, 9 A8, 11 B8, 12 B7, 13 B6, 14 B5, 15 B4, 16 B3, 17 B2, 18 B1, 19 !GBA

## 74*640N
designator V?, comment Octal bus TRANSCEIVER 3-state
footprint DIL20
part A pins: 20 +UB (power)
part B pins: 10 -UB (power)
part C pins: 1 DIR, 2 A1, 3 A2, 4 A3, 5 A4, 6 A5, 7 A6, 8 A7, 9 A8, 11 B8, 12 B7, 13 B6, 14 B5, 15 B4, 16 B3, 17 B2, 18 B1, 19 !G

## 74*643N
designator V?, comment Octal bus TRANSCEIVER 3-state
footprint DIL20
part A pins: 20 +UB (power)
part B pins: 10 -UB (power)
part C pins: 1 DIR, 2 A1, 3 A2, 4 A3, 5 A4, 6 A5, 7 A6, 8 A7, 9 A8, 11 B8, 12 B7, 13 B6, 14 B5, 15 B4, 16 B3, 17 B2, 18 B1, 19 !G

## 74*645N
designator V?, comment Octal bus TRANSCEIVER 3-state
footprint DIL20
part A pins: 20 +UB (power)
part B pins: 10 -UB (power)
part C pins: 1 DIR, 2 A1, 3 A2, 4 A3, 5 A4, 6 A5, 7 A6, 8 A7, 9 A8, 11 B8, 12 B7, 13 B6, 14 B5, 15 B4, 16 B3, 17 B2, 18 B1, 19 !G

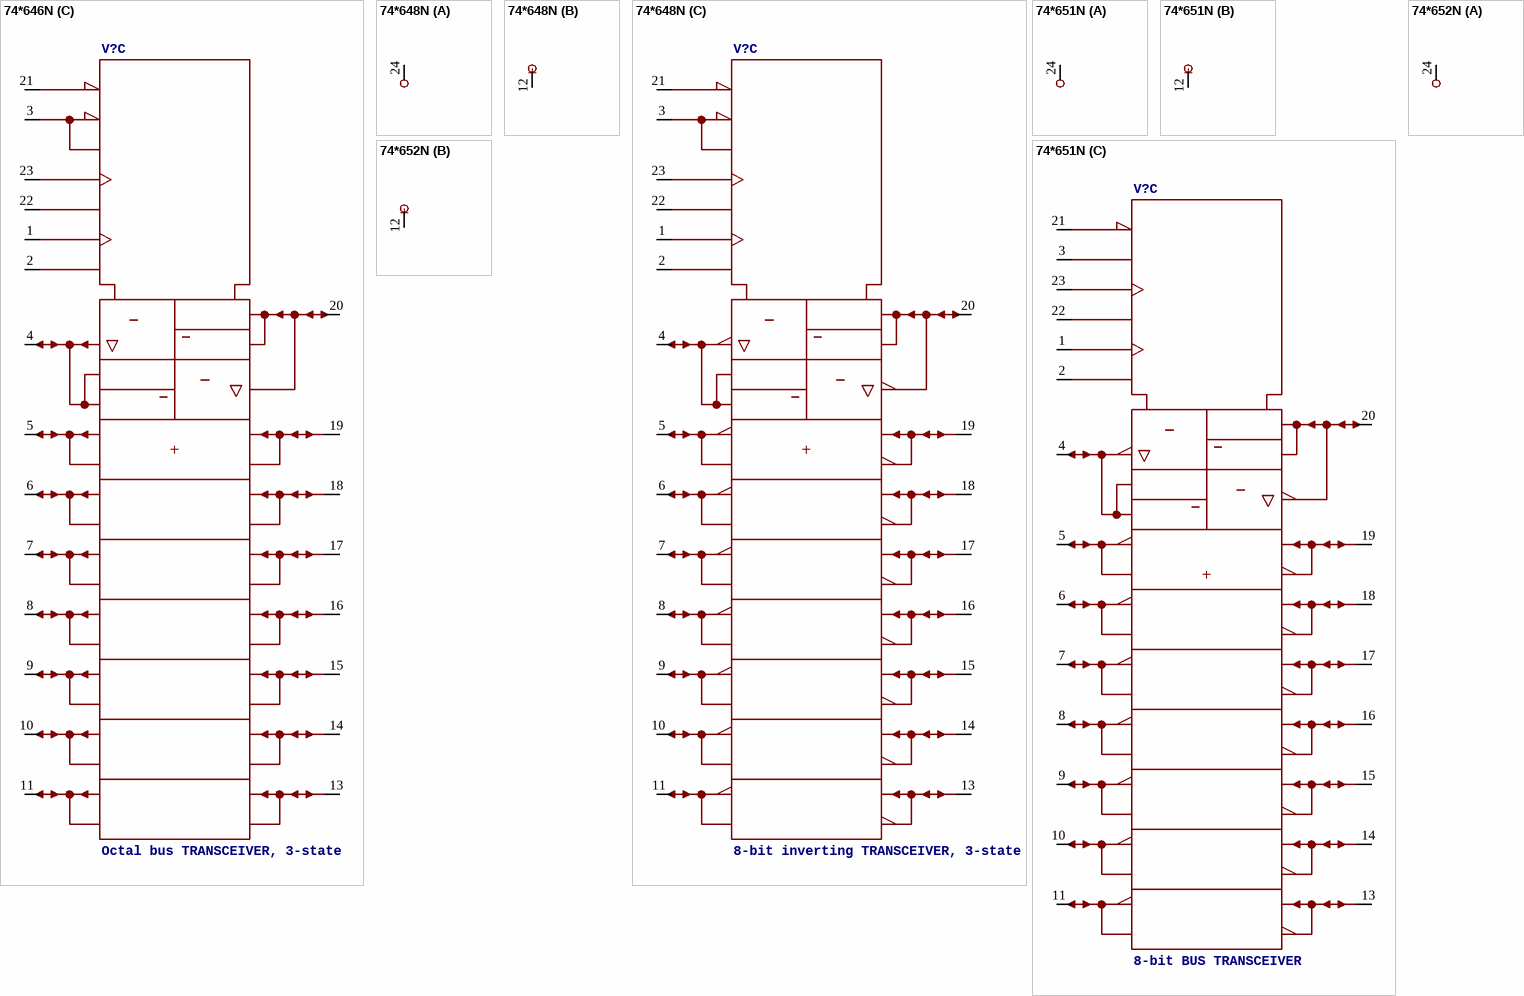
[diagram p14: symbols 74*646N to 74*652N]

## 74*646N
designator V?, comment Octal bus TRANSCEIVER, 3-state
footprint DIL24-3
part A pins: 24 +UB (power)
part B pins: 12 -UB (power)
part C pins: 1 CAB, 2 SAB, 3 DIR, 4 A1, 5 A2, 6 A3, 7 A4, 8 A5, 9 A6, 10 A7, 11 A8, 13 B8, 14 B7, 15 B6, 16 B5, 17 B4, 18 B3, 19 B2, 20 B1, 21 !G, 22 SBA, 23 CBA

## 74*648N
designator V?, comment 8-bit inverting TRANSCEIVER, 3-state
footprint DIL24-3
part A pins: 24 +UB (power)
part B pins: 12 -UB (power)
part C pins: 1 CAB, 2 SAB, 3 DIR, 4 A1, 5 A2, 6 A3, 7 A4, 8 A5, 9 A6, 10 A7, 11 A8, 13 B8, 14 B7, 15 B6, 16 B5, 17 B4, 18 B3, 19 B2, 20 B1, 21 !G, 22 SBA, 23 CBA

## 74*651N
designator V?, comment 8-bit BUS TRANSCEIVER
footprint DIL24-3
part A pins: 24 +UB (power)
part B pins: 12 -UB (power)
part C pins: 1 CAB, 2 SAB, 3 GAB, 4 A1, 5 A2, 6 A3, 7 A4, 8 A5, 9 A6, 10 A7, 11 A8, 13 B8, 14 B7, 15 B6, 16 B5, 17 B4, 18 B3, 19 B2, 20 B1, 21 !GBA, 22 SBA, 23 CBA

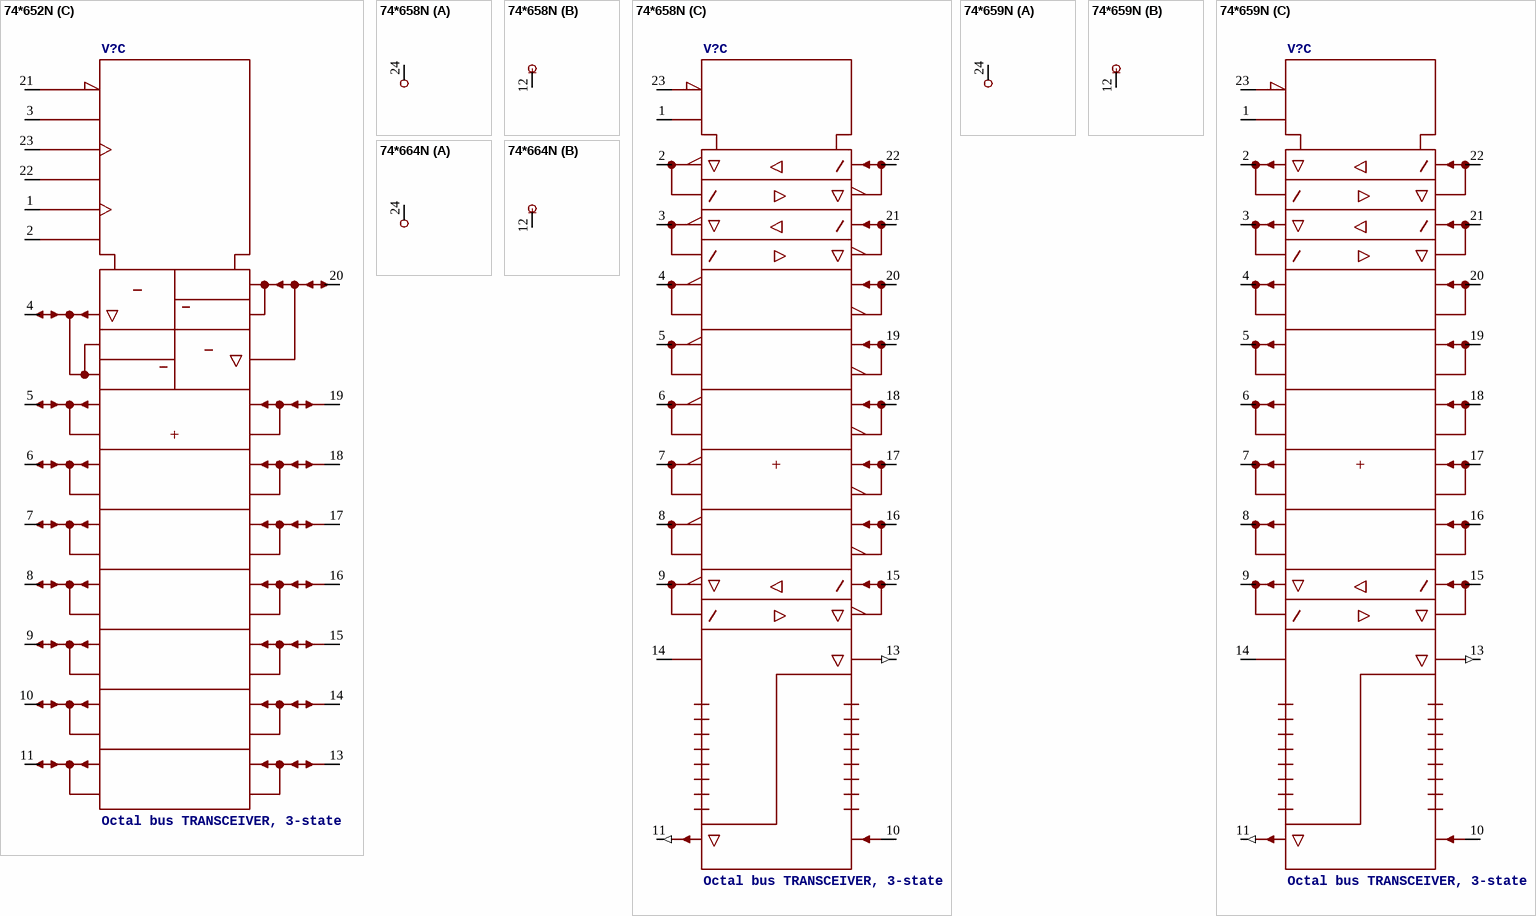
[diagram p15: symbols 74*652N to 74*664N]

## 74*652N
designator V?, comment Octal bus TRANSCEIVER, 3-state
footprint DIL24-3
part A pins: 24 +UB (power)
part B pins: 12 -UB (power)
part C pins: 1 CAB, 2 SAB, 3 GAB, 4 A1, 5 A2, 6 A3, 7 A4, 8 A5, 9 A6, 10 A7, 11 A8, 13 B8, 14 B7, 15 B6, 16 B5, 17 B4, 18 B3, 19 B2, 20 B1, 21 !GBA, 22 SBA, 23 CBA

## 74*658N
designator V?, comment Octal bus TRANSCEIVER, 3-state
footprint DIL24-3
part A pins: 24 +UB (power)
part B pins: 12 -UB (power)
part C pins: 1 GAB, 2 A1, 3 A2, 4 A3, 5 A4, 6 A5, 7 A6, 8 A7, 9 A8, 10 BPI, 11 BPO (out), 13 APO (out), 14 API, 15 B8, 16 B7, 17 B6, 18 B5, 19 B4, 20 B3, 21 B2, 22 B1, 23 !GBA

## 74*659N
designator V?, comment Octal bus TRANSCEIVER, 3-state
footprint DIL24-3
part A pins: 24 +UB (power)
part B pins: 12 -UB (power)
part C pins: 1 GAB, 2 A1, 3 A2, 4 A3, 5 A4, 6 A5, 7 A6, 8 A7, 9 A8, 10 BPI, 11 BPO (out), 13 APO (out), 14 API, 15 B8, 16 B7, 17 B6, 18 B5, 19 B4, 20 B3, 21 B2, 22 B1, 23 !GBA

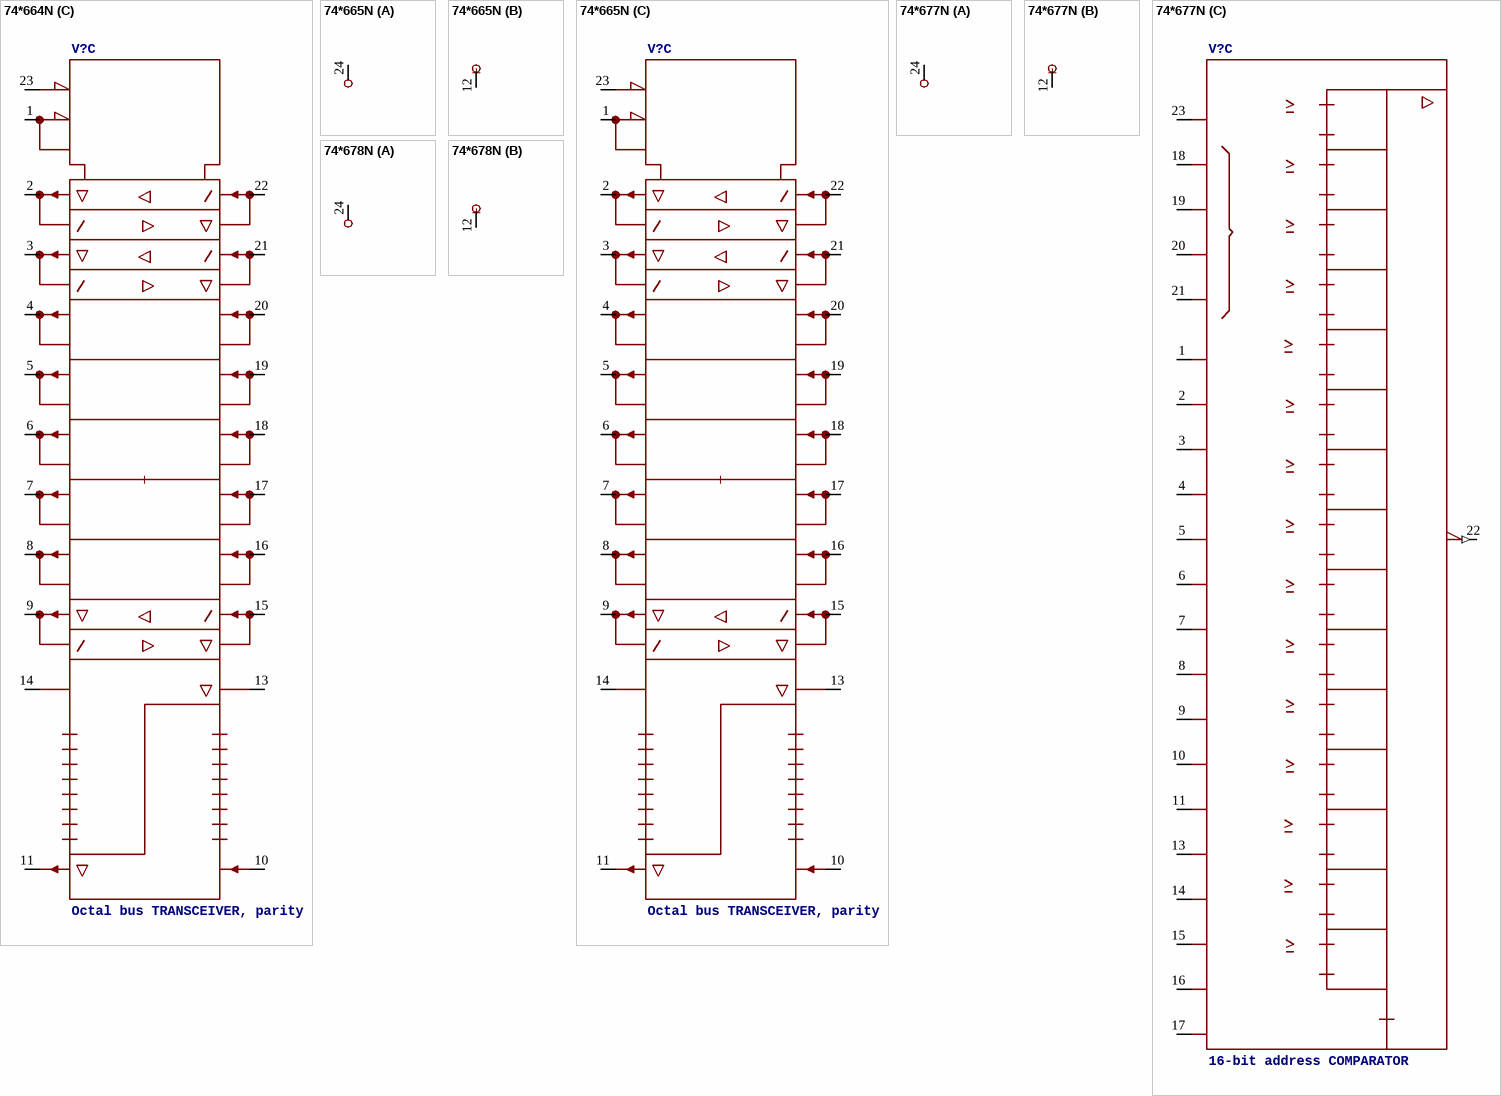
[diagram p16: symbols 74*664N to 74*678N]

## 74*664N
designator V?, comment Octal bus TRANSCEIVER, parity
footprint DIL24-3
part A pins: 24 +UB (power)
part B pins: 12 -UB (power)
part C pins: 1 DIR, 2 A1, 3 A2, 4 A3, 5 A4, 6 A5, 7 A6, 8 A7, 9 A8, 10 BPI, 11 BPO (hiz), 13 APO (hiz), 14 API, 15 B8, 16 B7, 17 B6, 18 B5, 19 B4, 20 B3, 21 B2, 22 B1, 23 !G

## 74*665N
designator V?, comment Octal bus TRANSCEIVER, parity
footprint DIL24-3
part A pins: 24 +UB (power)
part B pins: 12 -UB (power)
part C pins: 1 DIR, 2 A1, 3 A2, 4 A3, 5 A4, 6 A5, 7 A6, 8 A7, 9 A8, 10 BPI, 11 BPO (hiz), 13 APO (hiz), 14 API, 15 B8, 16 B7, 17 B6, 18 B5, 19 B4, 20 B3, 21 B2, 22 B1, 23 !G

## 74*677N
designator V?, comment 16-bit address COMPARATOR
footprint DIL24-3
part A pins: 24 +UB (power)
part B pins: 12 -UB (power)
part C pins: 1 A1, 2 A2, 3 A3, 4 A4, 5 A5, 6 A6, 7 A7, 8 A8, 9 A9, 10 A10, 11 A11, 13 A12, 14 A13, 15 A14, 16 A15, 17 A16, 18 P0, 19 P1, 20 P2, 21 P3, 22 Y (out), 23 !G

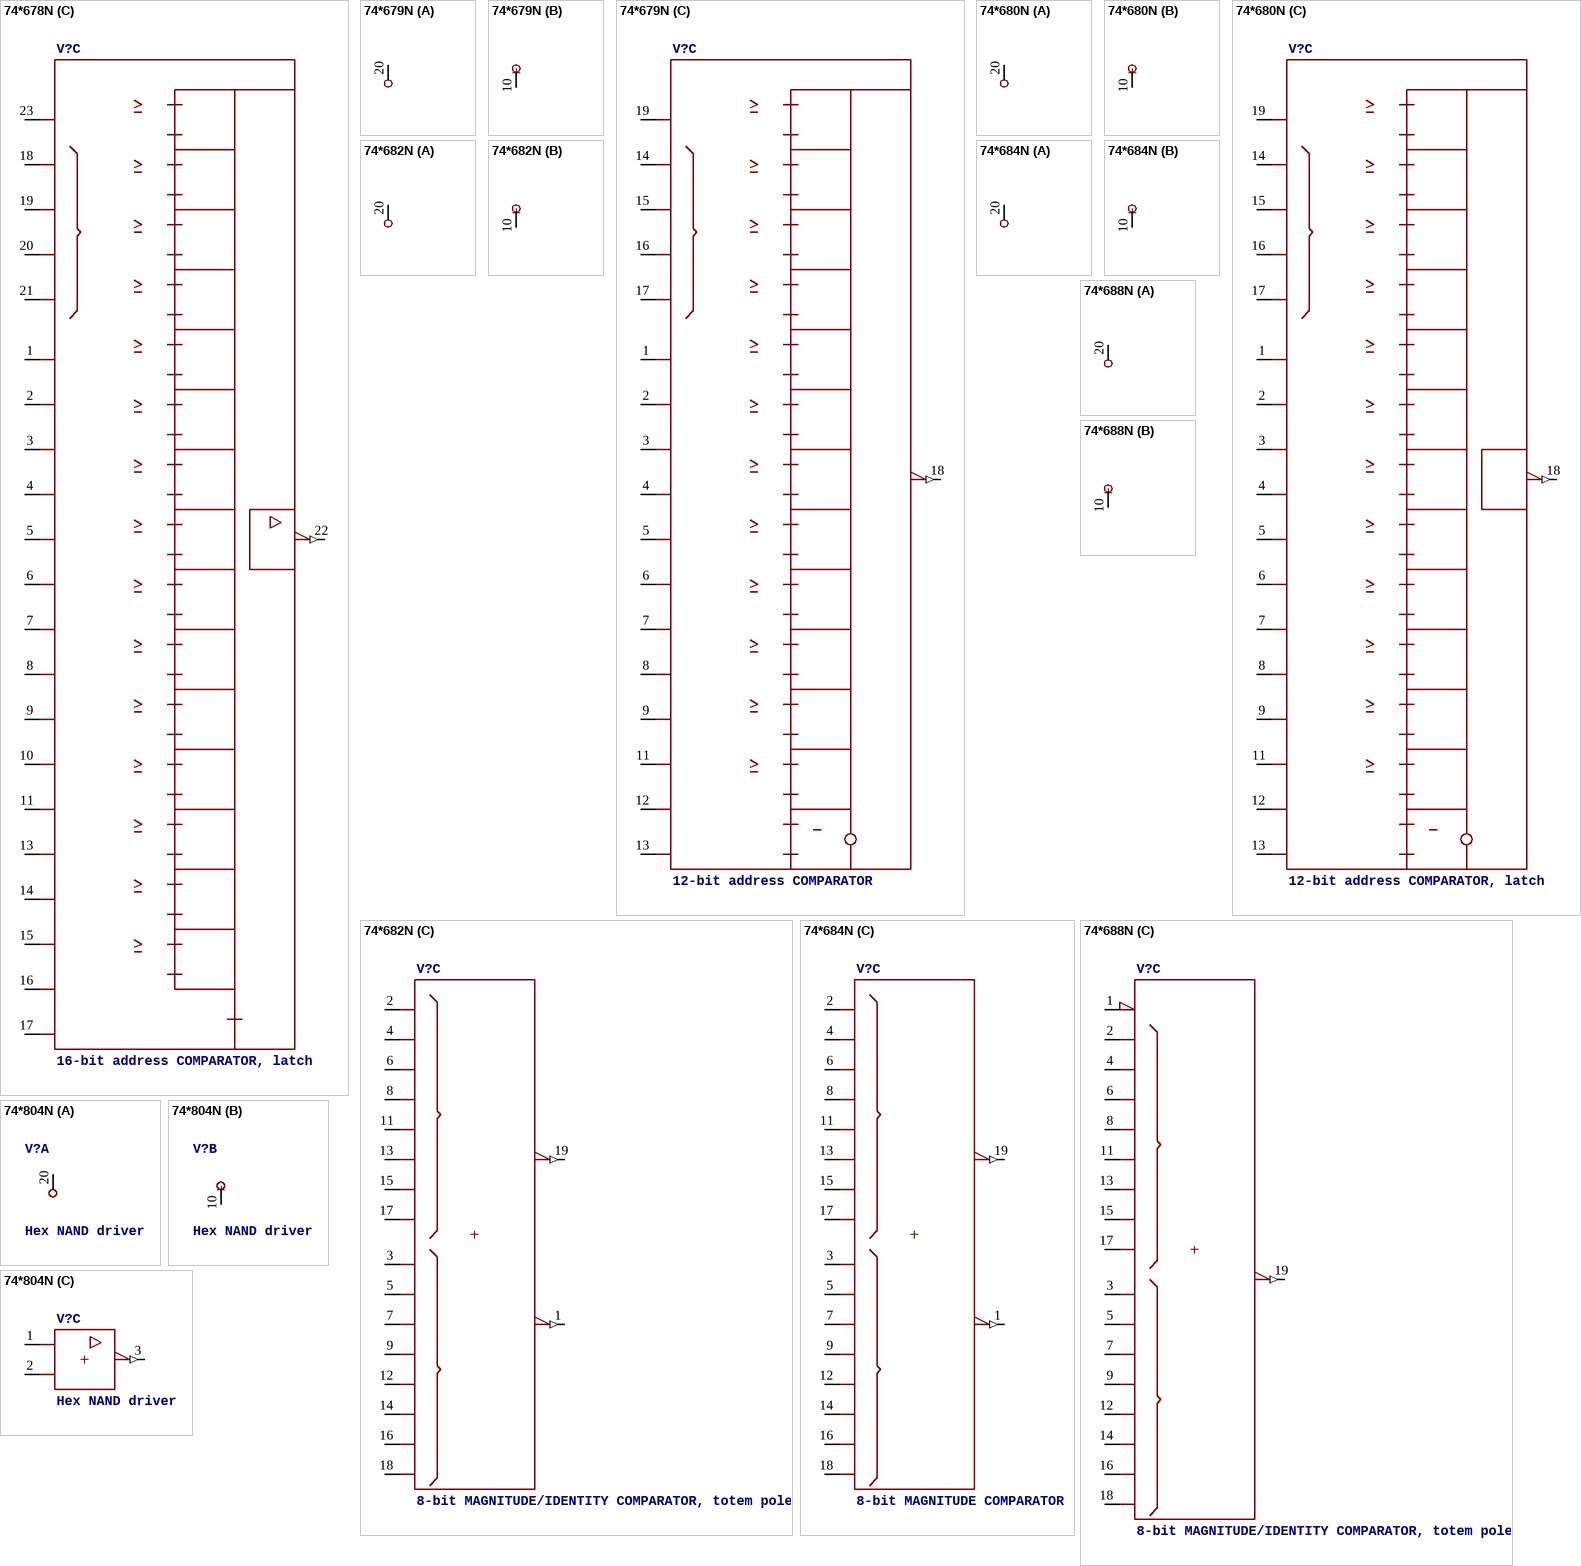
[diagram p17: symbols 74*678N to 74*804N]

## 74*678N
designator V?, comment 16-bit address COMPARATOR, latch
footprint DIL24-3
part A pins: 24 +UB (power)
part B pins: 12 -UB (power)
part C pins: 1 A1, 2 A2, 3 A3, 4 A4, 5 A5, 6 A6, 7 A7, 8 A8, 9 A9, 10 A10, 11 A11, 13 A12, 14 A13, 15 A14, 16 A15, 17 A16, 18 P0, 19 P1, 20 P2, 21 P3, 22 Y (out), 23 C

## 74*679N
designator V?, comment 12-bit address COMPARATOR
footprint DIL20
part A pins: 20 +UB (power)
part B pins: 10 -UB (power)
part C pins: 1 A1, 2 A2, 3 A3, 4 A4, 5 A5, 6 A6, 7 A7, 8 A8, 9 A9, 11 A10, 12 A11, 13 A12, 14 P0, 15 P1, 16 P2, 17 P3, 18 Y (out), 19 !G

## 74*680N
designator V?, comment 12-bit address COMPARATOR, latch
footprint DIL20
part A pins: 20 +UB (power)
part B pins: 10 -UB (power)
part C pins: 1 A1, 2 A2, 3 A3, 4 A4, 5 A5, 6 A6, 7 A7, 8 A8, 9 A9, 11 A10, 12 A11, 13 A12, 14 P0, 15 P1, 16 P2, 17 P3, 18 Y (out), 19 C

## 74*682N
designator V?, comment 8-bit MAGNITUDE/IDENTITY COMPARATOR, totem pole
footprint DIL20
part A pins: 20 +UB (power)
part B pins: 10 -UB (power)
part C pins: 1 !P>Q (out), 2 P0, 3 Q0, 4 P1, 5 Q1, 6 P2, 7 Q2, 8 P3, 9 Q3, 11 P4, 12 Q4, 13 P5, 14 Q5, 15 P6, 16 Q6, 17 P7, 18 Q7, 19 !P=Q (out)

## 74*684N
designator V?, comment 8-bit MAGNITUDE COMPARATOR
footprint DIL20
part A pins: 20 +UB (power)
part B pins: 10 -UB (power)
part C pins: 1 !P>Q (out), 2 P0, 3 Q0, 4 P1, 5 Q1, 6 P2, 7 Q2, 8 P3, 9 Q3, 11 P4, 12 Q4, 13 P5, 14 Q5, 15 P6, 16 Q6, 17 P7, 18 Q7, 19 !P=Q (out)

## 74*688N
designator V?, comment 8-bit MAGNITUDE/IDENTITY COMPARATOR, totem pole
footprint DIL20
part A pins: 20 +UB (power)
part B pins: 10 -UB (power)
part C pins: 1 !G, 2 P0, 3 Q0, 4 P1, 5 Q1, 6 P2, 7 Q2, 8 P3, 9 Q3, 11 P4, 12 Q4, 13 P5, 14 Q5, 15 P6, 16 Q6, 17 P7, 18 Q7, 19 !P=Q (out)

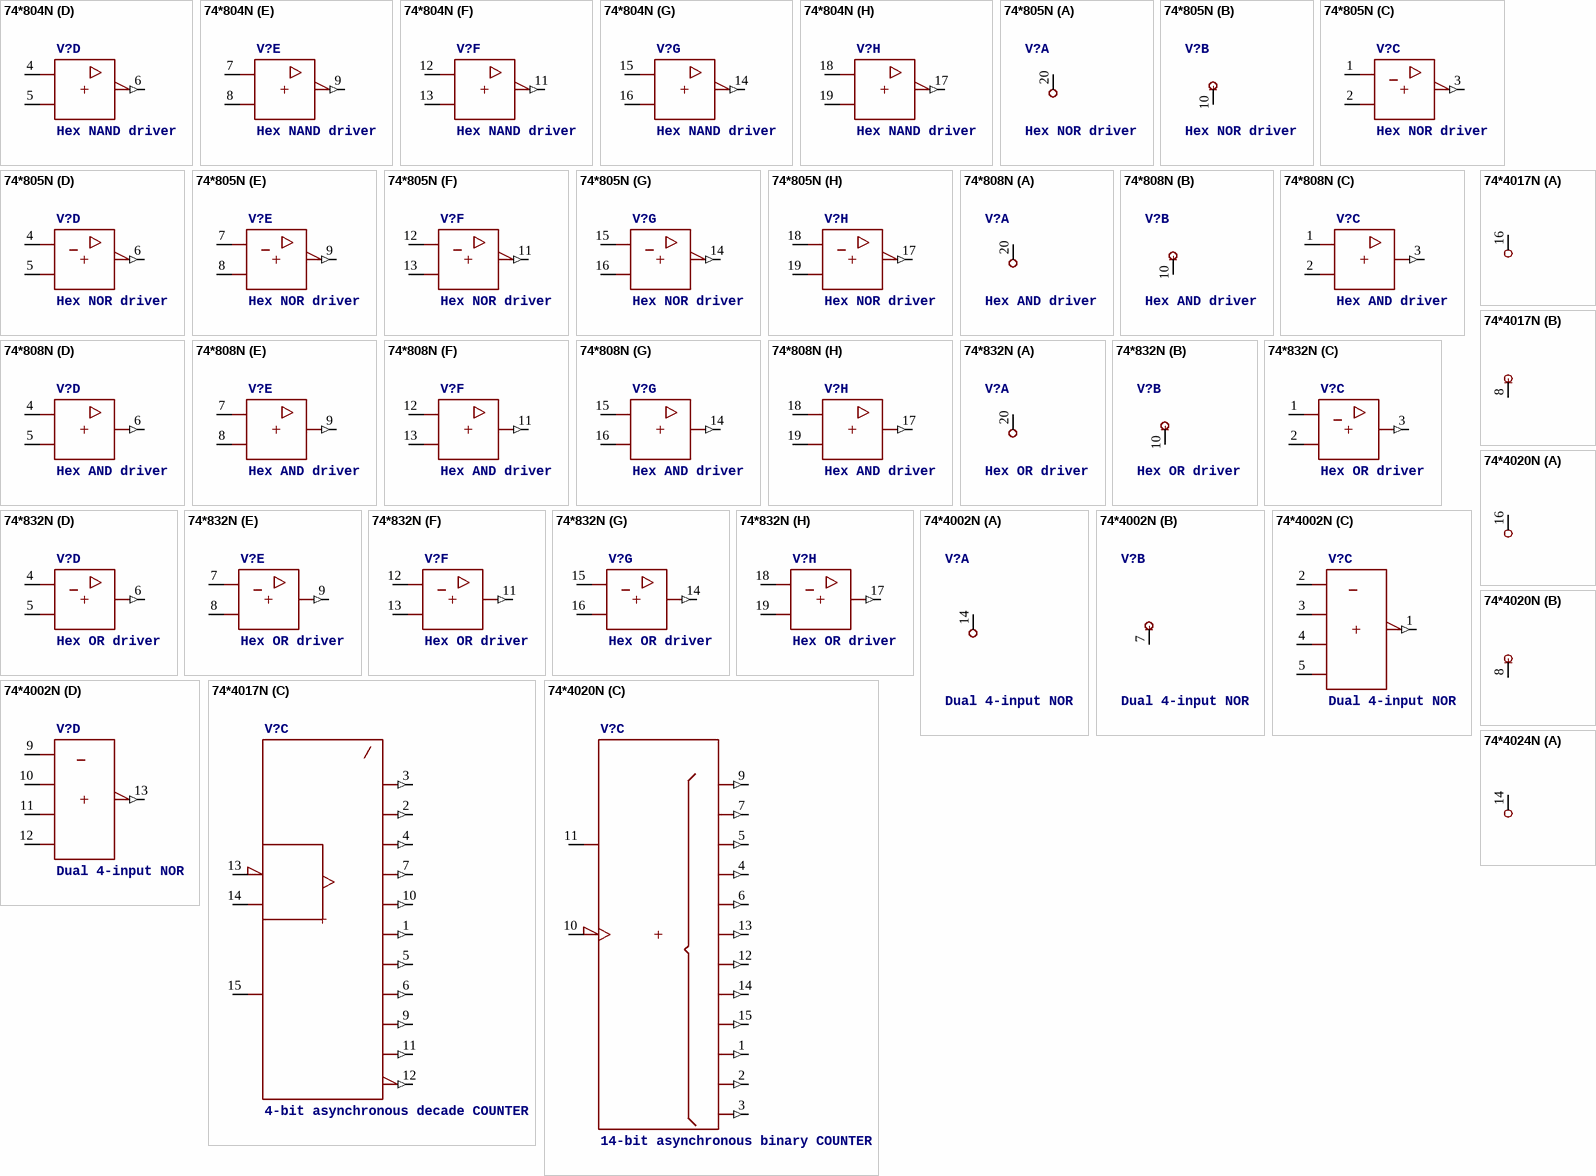
[diagram p18: symbols 74*804N to 74*4024N]

## 74*804N
designator V?, comment Hex NAND driver
footprint DIL20
part A pins: 20 +UB (power)
part B pins: 10 -UB (power)
part C pins: 1 A, 2 B, 3 Y (out)
part D pins: 4 A, 5 B, 6 Y (out)
part E pins: 7 A, 8 B, 9 Y (out)
part F pins: 11 Y (out), 12 A, 13 B
part G pins: 14 Y (out), 15 A, 16 B
part H pins: 17 Y (out), 18 A, 19 B

## 74*805N
designator V?, comment Hex NOR driver
footprint DIL20
part A pins: 20 +UB (power)
part B pins: 10 -UB (power)
part C pins: 1 A, 2 B, 3 Y (out)
part D pins: 4 A, 5 B, 6 Y (out)
part E pins: 7 A, 8 B, 9 Y (out)
part F pins: 11 Y (out), 12 A, 13 B
part G pins: 14 Y (out), 15 A, 16 B
part H pins: 17 Y (out), 18 A, 19 B

## 74*808N
designator V?, comment Hex AND driver
footprint DIL20
part A pins: 20 +UB (power)
part B pins: 10 -UB (power)
part C pins: 1 A, 2 B, 3 Y (out)
part D pins: 4 A, 5 B, 6 Y (out)
part E pins: 7 A, 8 B, 9 Y (out)
part F pins: 11 Y (out), 12 A, 13 B
part G pins: 14 Y (out), 15 A, 16 B
part H pins: 17 Y (out), 18 A, 19 B

## 74*832N
designator V?, comment Hex OR driver
footprint DIL20
part A pins: 20 +UB (power)
part B pins: 10 -UB (power)
part C pins: 1 A, 2 B, 3 Y (out)
part D pins: 4 A, 5 B, 6 Y (out)
part E pins: 7 A, 8 B, 9 Y (out)
part F pins: 11 Y (out), 12 A, 13 B
part G pins: 14 Y (out), 15 A, 16 B
part H pins: 17 Y (out), 18 A, 19 B

## 74*4002N
designator V?, comment Dual 4-input NOR
footprint DIL14
part A pins: 14 +UB (power)
part B pins: 7 -UB (power)
part C pins: 1 Y (out), 2 A, 3 B, 4 C, 5 D
part D pins: 9 A, 10 B, 11 C, 12 D, 13 Y (out)

## 74*4017N
designator V?, comment 4-bit asynchronous decade COUNTER
footprint DIL16
part A pins: 16 +UB (power)
part B pins: 8 -UB (power)
part C pins: 1 Y5 (out), 2 Y1 (out), 3 Y0 (out), 4 Y2 (out), 5 Y6 (out), 6 Y7 (out), 7 Y3 (out), 9 Y8 (out), 10 Y4 (out), 11 Y9 (out), 12 CO (out), 13 !CLKEN, 14 CLK, 15 CLR

## 74*4020N
designator V?, comment 14-bit asynchronous binary COUNTER
footprint DIL16
part A pins: 16 +UB (power)
part B pins: 8 -UB (power)
part C pins: 1 QL (out), 2 QM (out), 3 QN (out), 4 QF (out), 5 QE (out), 6 QG (out), 7 QD (out), 9 QA (out), 10 CLK, 11 CLR, 12 QI (out), 13 QH (out), 14 QJ (out), 15 QK (out)

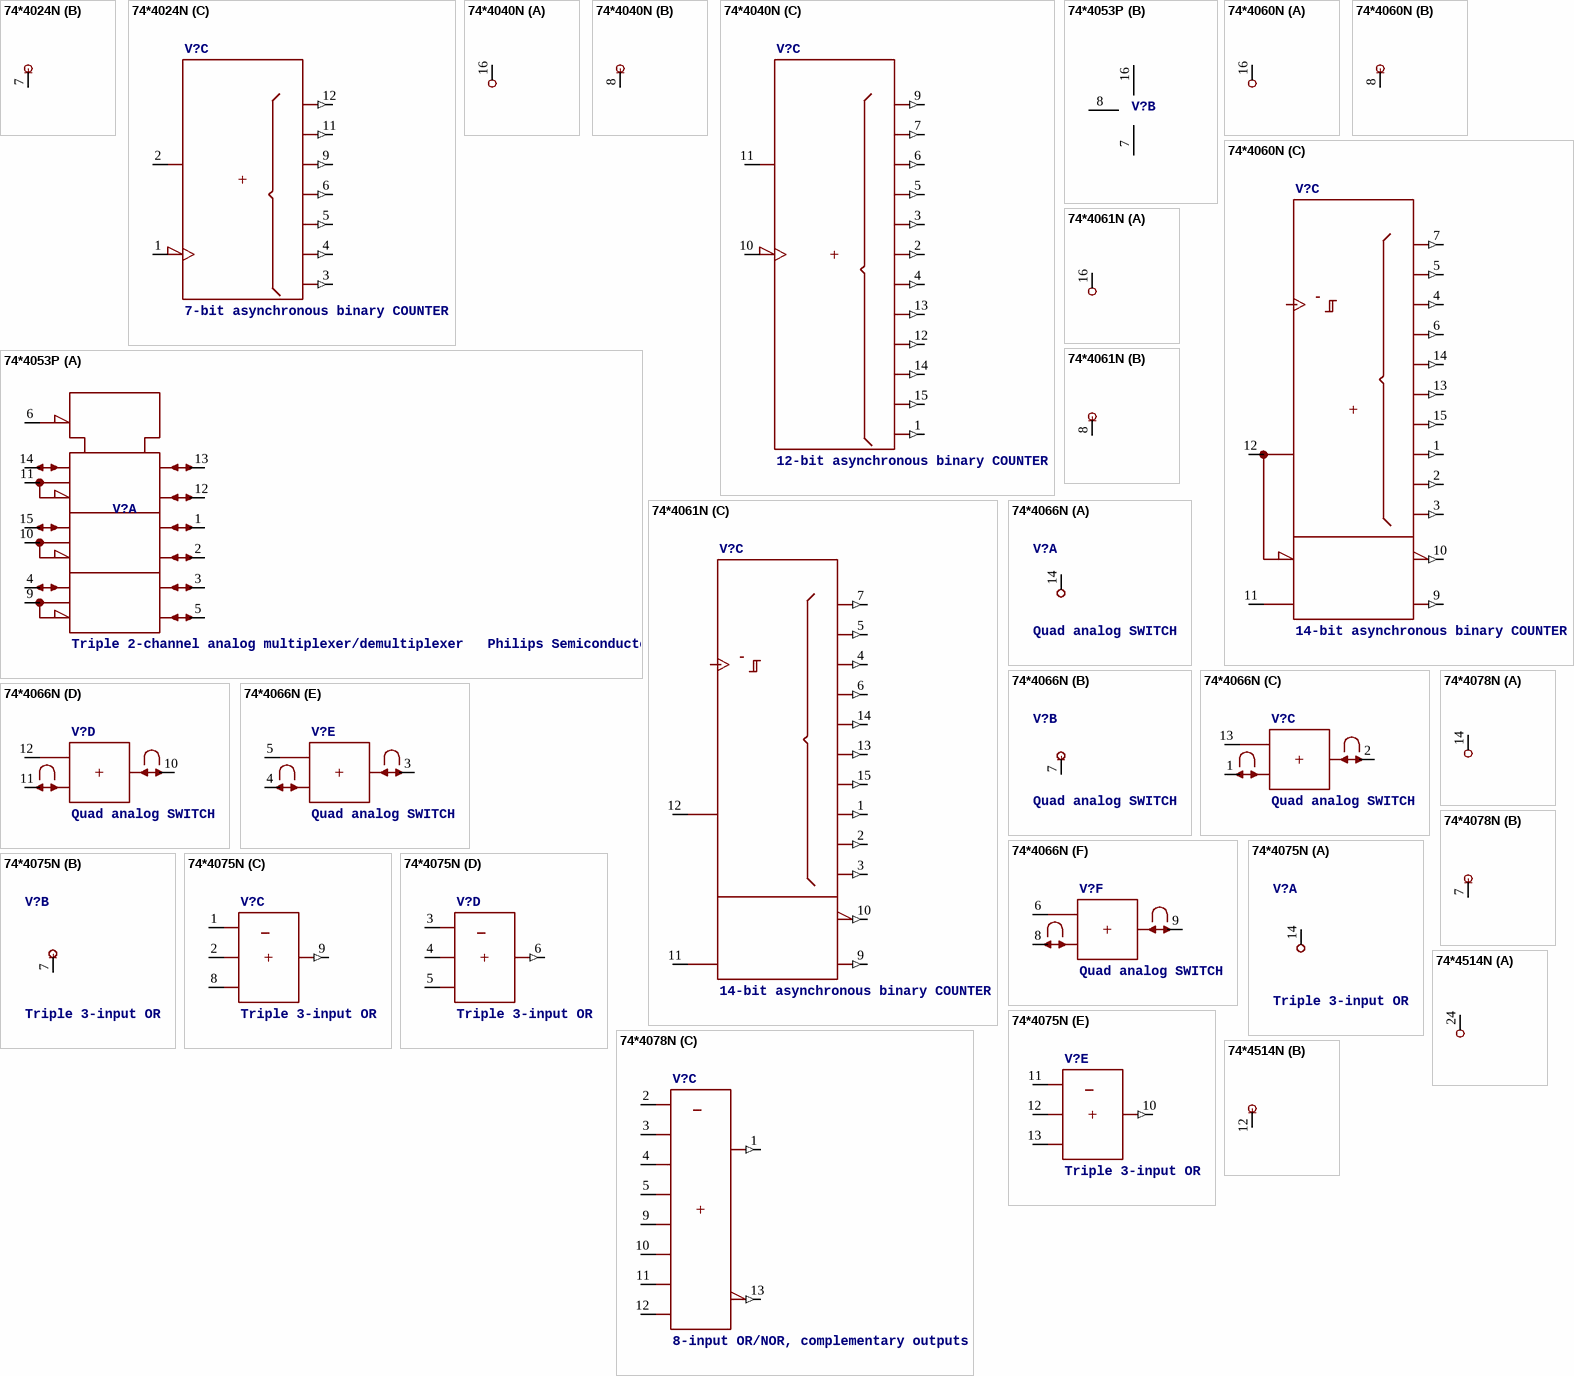
[diagram p19: symbols 74*4024N to 74*4514N]

## 74*4024N
designator V?, comment 7-bit asynchronous binary COUNTER
footprint DIL14
part A pins: 14 +UB (power)
part B pins: 7 -UB (power)
part C pins: 1 CLK, 2 CLR, 3 QG (out), 4 QF (out), 5 QE (out), 6 QD (out), 9 QC (out), 11 QB (out), 12 QA (out)

## 74*4040N
designator V?, comment 12-bit asynchronous binary COUNTER
footprint DIL16
part A pins: 16 +UB (power)
part B pins: 8 -UB (power)
part C pins: 1 QL (out), 2 QF (out), 3 QE (out), 4 QG (out), 5 QD (out), 6 QC (out), 7 QB (out), 9 QA (out), 10 CLK, 11 CLR, 12 QI (out), 13 QH (out), 14 QJ (out), 15 QK (out)

## 74*4053P
designator V?, comment Triple 2-channel analog multiplexer/demultiplexer   Philips Semiconductor
footprint DIL16
part A pins: 1, 2, 3, 4, 5, 6 !G, 9, 10, 11, 12, 13, 14, 15
part B pins: 7 VEE (power), 8 GND (power), 16 VCC (power)

## 74*4060N
designator V?, comment 14-bit asynchronous binary COUNTER
footprint DIL16
part A pins: 16 +UB (power)
part B pins: 8 -UB (power)
part C pins: 1 QL (out), 2 QM (out), 3 QN (out), 4 QF (out), 5 QE (out), 6 QG (out), 7 QD (out), 9 CKO (out), 10 !CKO (out), 11 CKI, 12 CLR, 13 QI (out), 14 QH (out), 15 QJ (out)

## 74*4061N
designator V?, comment 14-bit asynchronous binary COUNTER
footprint DIL16
part A pins: 16 +UB (power)
part B pins: 8 -UB (power)
part C pins: 1 QL (out), 2 QM (out), 3 QN (out), 4 QF (out), 5 QE (out), 6 QG (out), 7 QD (out), 9 CKO (out), 10 !CKO (out), 11 CKI, 12 CLR, 13 QI (out), 14 QH (out), 15 QJ (out)

## 74*4066N
designator V?, comment Quad analog SWITCH
footprint DIL14
part A pins: 14 +UB (power)
part B pins: 7 -UB (power)
part C pins: 1 A, 2 B, 13 C
part D pins: 10 B, 11 A, 12 C
part E pins: 3 B, 4 A, 5 C
part F pins: 6 C, 8 A, 9 B

## 74*4075N
designator V?, comment Triple 3-input OR
footprint DIL14
part A pins: 14 +UB (power)
part B pins: 7 -UB (power)
part C pins: 1 A, 2 B, 8 C, 9 Y (out)
part D pins: 3 A, 4 B, 5 C, 6 Y (out)
part E pins: 10 Y (out), 11 A, 12 B, 13 C

## 74*4078N
designator V?, comment 8-input OR/NOR, complementary outputs
footprint DIL14
part A pins: 14 +UB (power)
part B pins: 7 -UB (power)
part C pins: 1 Y (out), 2 A, 3 B, 4 C, 5 D, 9 E, 10 F, 11 G, 12 H, 13 W (out)

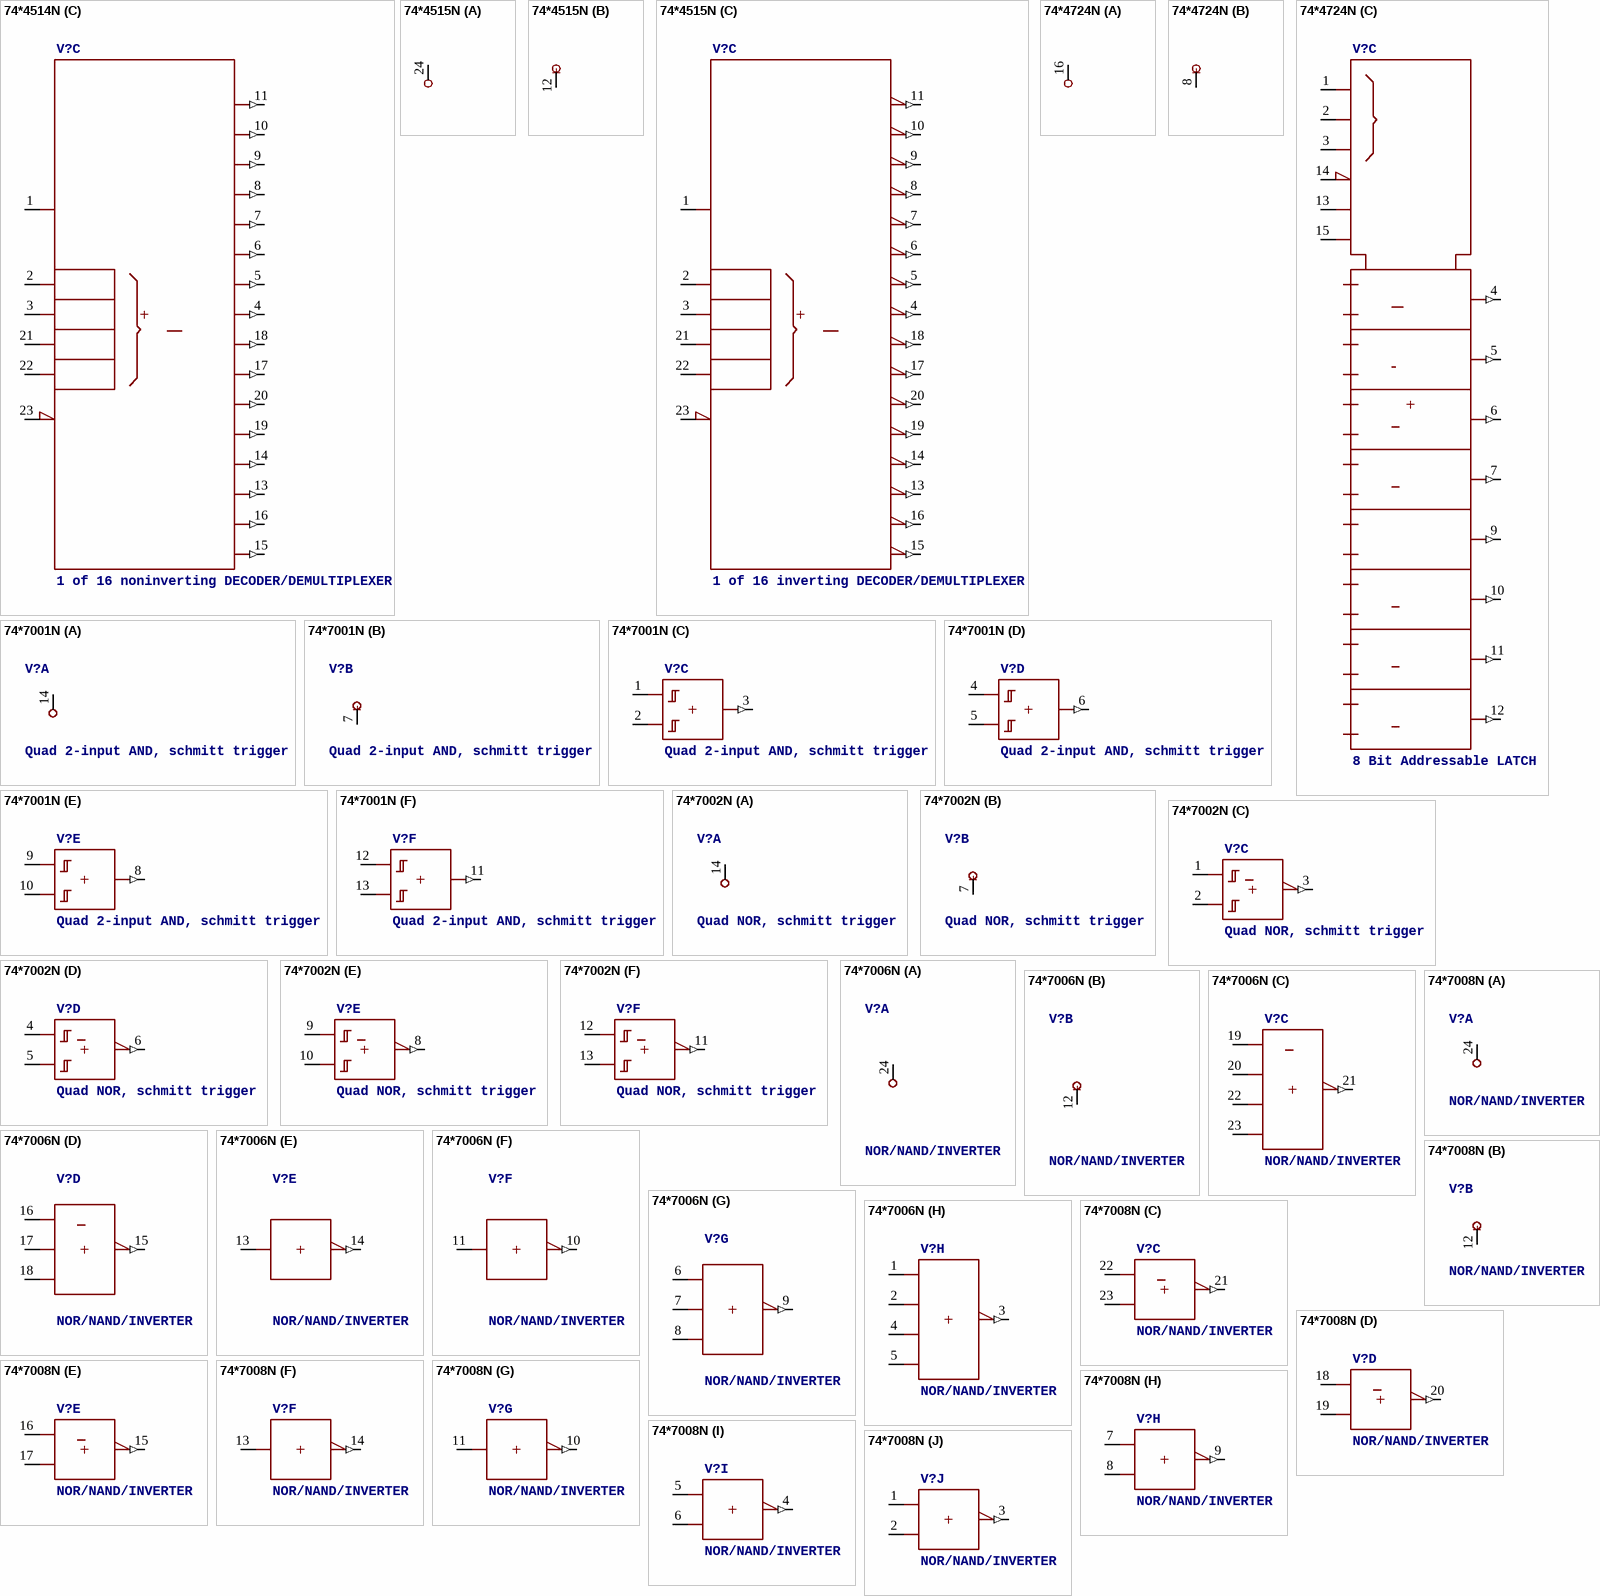
[diagram p20: symbols 74*4514N to 74*7008N]

## 74*4514N
designator V?, comment 1 of 16 noninverting DECODER/DEMULTIPLEXER
footprint DIL24-3
part A pins: 24 +UB (power)
part B pins: 12 -UB (power)
part C pins: 1 LE, 2 A, 3 B, 4 Y7 (out), 5 Y6 (out), 6 Y5 (out), 7 Y4 (out), 8 Y3 (out), 9 Y2 (out), 10 Y1 (out), 11 Y0 (out), 13 Y13 (out), 14 Y12 (out), 15 Y15 (out), 16 Y14 (out), 17 Y9 (out), 18 Y8 (out), 19 Y11 (out), 20 Y10 (out), 21 C, 22 D, 23 !G

## 74*4515N
designator V?, comment 1 of 16 inverting DECODER/DEMULTIPLEXER
footprint DIL24-3
part A pins: 24 +UB (power)
part B pins: 12 -UB (power)
part C pins: 1 LE, 2 A, 3 B, 4 Y7 (out), 5 Y6 (out), 6 Y5 (out), 7 Y4 (out), 8 Y3 (out), 9 Y2 (out), 10 Y1 (out), 11 Y0 (out), 13 Y13 (out), 14 Y12 (out), 15 Y15 (out), 16 Y14 (out), 17 Y9 (out), 18 Y8 (out), 19 Y11 (out), 20 Y10 (out), 21 C, 22 D, 23 !G

## 74*4724N
designator V?, comment 8 Bit Addressable LATCH
footprint DIL16
part A pins: 16 +UB (power)
part B pins: 8 -UB (power)
part C pins: 1 S0, 2 S1, 3 S2, 4 Q0 (out), 5 Q1 (out), 6 Q2 (out), 7 Q3 (out), 9 Q4 (out), 10 Q5 (out), 11 Q6 (out), 12 Q7 (out), 13 D, 14 !G, 15 CLR

## 74*7001N
designator V?, comment Quad 2-input AND, schmitt trigger
footprint DIL14
part A pins: 14 +UB (power)
part B pins: 7 -UB (power)
part C pins: 1 A, 2 B, 3 Y (out)
part D pins: 4 A, 5 B, 6 Y (out)
part E pins: 8 Y (out), 9 A, 10 B
part F pins: 11 Y (out), 12 A, 13 B

## 74*7002N
designator V?, comment Quad NOR, schmitt trigger
footprint DIL14
part A pins: 14 +UB (power)
part B pins: 7 -UB (power)
part C pins: 1 A, 2 B, 3 Y (out)
part D pins: 4 A, 5 B, 6 Y (out)
part E pins: 8 Y (out), 9 A, 10 B
part F pins: 11 Y (out), 12 A, 13 B

## 74*7006N
designator V?, comment NOR/NAND/INVERTER
footprint DIL24-3
part A pins: 24 +UB (power)
part B pins: 12 -UB (power)
part C pins: 19 A, 20 B, 21 Y (out), 22 C, 23 D
part D pins: 15 Y (out), 16 A, 17 B, 18 C
part E pins: 13 A, 14 Y (out)
part F pins: 10 Y (out), 11 A
part G pins: 6 A, 7 B, 8 C, 9 Y (out)
part H pins: 1 A, 2 B, 3 Y (out), 4 C, 5 D

## 74*7008N
designator V?, comment NOR/NAND/INVERTER
footprint DIL24-3
part A pins: 24 +UB (power)
part B pins: 12 -UB (power)
part C pins: 21 Y (out), 22 A, 23 B
part D pins: 18 A, 19 B, 20 Y (out)
part E pins: 15 Y (out), 16 A, 17 B
part F pins: 13 A, 14 Y (out)
part G pins: 10 Y (out), 11 A
part H pins: 7 A, 8 B, 9 Y (out)
part I pins: 4 Y (out), 5 A, 6 B
part J pins: 1 A, 2 B, 3 Y (out)

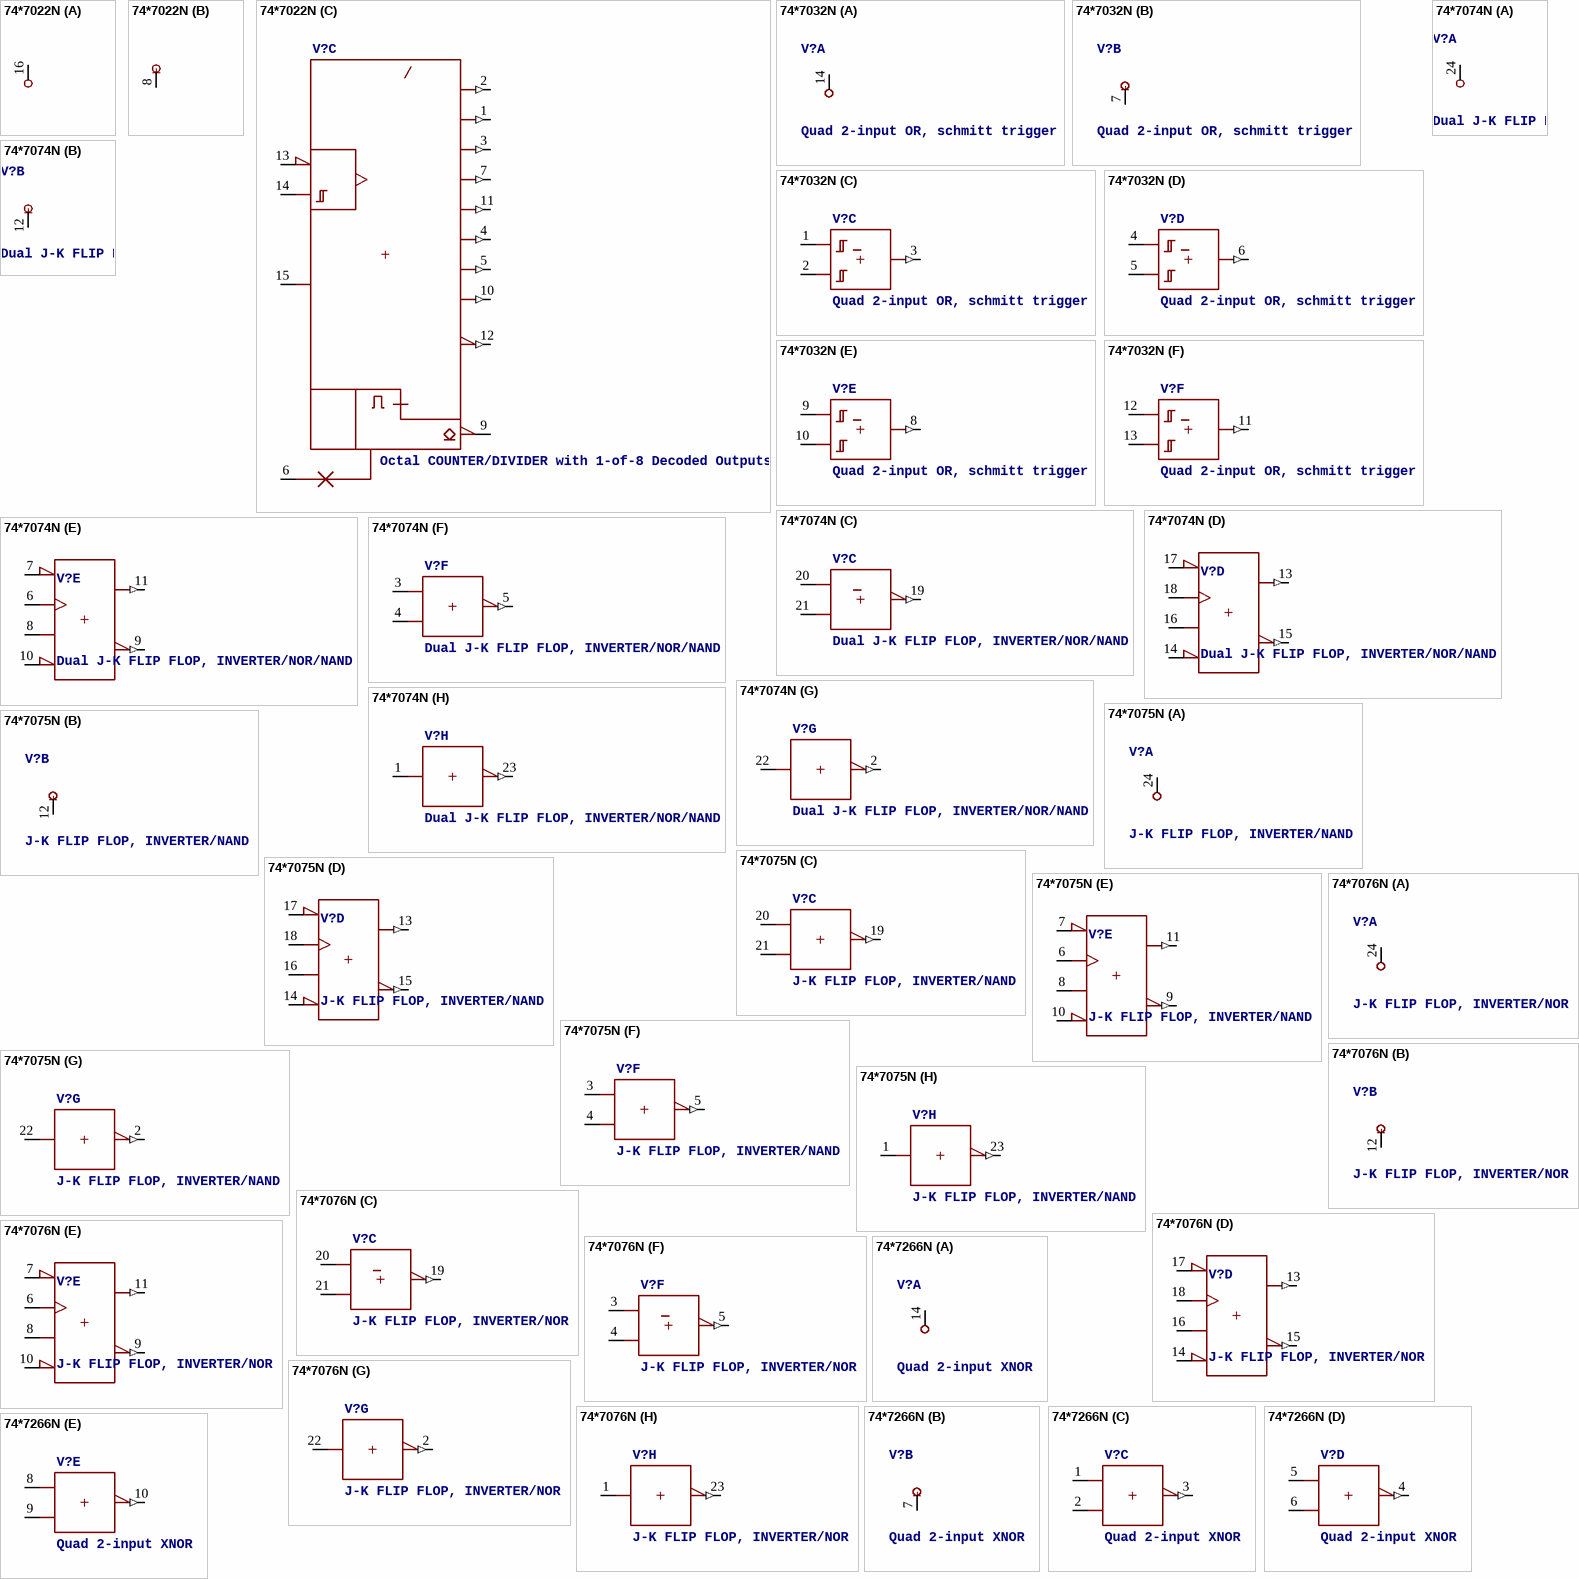
[diagram p21: symbols 74*7022N to 74*7266N]

## 74*7022N
designator V?, comment Octal COUNTER/DIVIDER with 1-of-8 Decoded Outputs
footprint DIL16
part A pins: 16 +UB (power)
part B pins: 8 -UB (power)
part C pins: 1 Y1 (out), 2 Y0 (out), 3 Y2 (out), 4 Y5 (out), 5 Y6 (out), 6 XCAP, 7 Y3 (out), 9 !CLROUT (oc), 10 Y7 (out), 11 Y4 (out), 12 CO (out), 13 !CLKEN, 14 CLK, 15 CLR

## 74*7032N
designator V?, comment Quad 2-input OR, schmitt trigger
footprint DIL14
part A pins: 14 +UB (power)
part B pins: 7 -UB (power)
part C pins: 1 A, 2 B, 3 Y (out)
part D pins: 4 A, 5 B, 6 Y (out)
part E pins: 8 Y (out), 9 A, 10 B
part F pins: 11 Y (out), 12 A, 13 B

## 74*7074N
designator V?, comment Dual J-K FLIP FLOP, INVERTER/NOR/NAND
footprint DIL24-3
part A pins: 24 +UB (power)
part B pins: 12 -UB (power)
part C pins: 19 Y (out), 20 A, 21 B
part D pins: 13 Q (out), 14 !CLR, 15 !Q (out), 16 D, 17 !PRE, 18 CLK
part E pins: 6 CLK, 7 !PRE, 8 D, 9 !Q (out), 10 !CLR, 11 Q (out)
part F pins: 3 A, 4 B, 5 Y (out)
part G pins: 2 Y (out), 22 A
part H pins: 1 A, 23 Y (out)

## 74*7075N
designator V?, comment J-K FLIP FLOP, INVERTER/NAND
footprint DIL24-3
part A pins: 24 +UB (power)
part B pins: 12 -UB (power)
part C pins: 19 Y (out), 20 A, 21 B
part D pins: 13 Q (out), 14 !CLR, 15 !Q (out), 16 D, 17 !PRE, 18 CLK
part E pins: 6 CLK, 7 !PRE, 8 D, 9 !Q (out), 10 !CLR, 11 Q (out)
part F pins: 3 A, 4 B, 5 Y (out)
part G pins: 2 Y (out), 22 A
part H pins: 1 A, 23 Y (out)

## 74*7076N
designator V?, comment J-K FLIP FLOP, INVERTER/NOR
footprint DIL24-3
part A pins: 24 +UB (power)
part B pins: 12 -UB (power)
part C pins: 19 Y (out), 20 A, 21 B
part D pins: 13 Q (out), 14 !CLR, 15 !Q (out), 16 D, 17 !PRE, 18 CLK
part E pins: 6 CLK, 7 !PRE, 8 D, 9 !Q (out), 10 !CLR, 11 Q (out)
part F pins: 3 A, 4 B, 5 Y (out)
part G pins: 2 Y (out), 22 A
part H pins: 1 A, 23 Y (out)

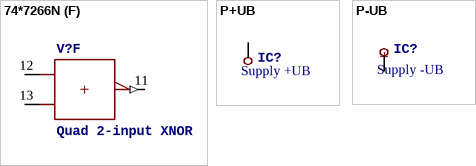
[diagram p22: symbols 74*7266N to P-UB]

## 74*7266N
designator V?, comment Quad 2-input XNOR
footprint DIL14
part A pins: 14 +UB (power)
part B pins: 7 -UB (power)
part C pins: 1 A, 2 B, 3 Y (out)
part D pins: 4 Y (out), 5 A, 6 B
part E pins: 8 A, 9 B, 10 Y (out)
part F pins: 11 Y (out), 12 A, 13 B

## P+UB
designator IC?, comment Supply +UB
pins: ?1 +UB (power)

## P-UB
designator IC?, comment Supply -UB
pins: ?1 -UB (power)